# Altium schematic symbol library my_lib.SchLib: 341 symbols (part 1 of 2)
Pins are listed as number, name and electrical type; pins without a type are passive.

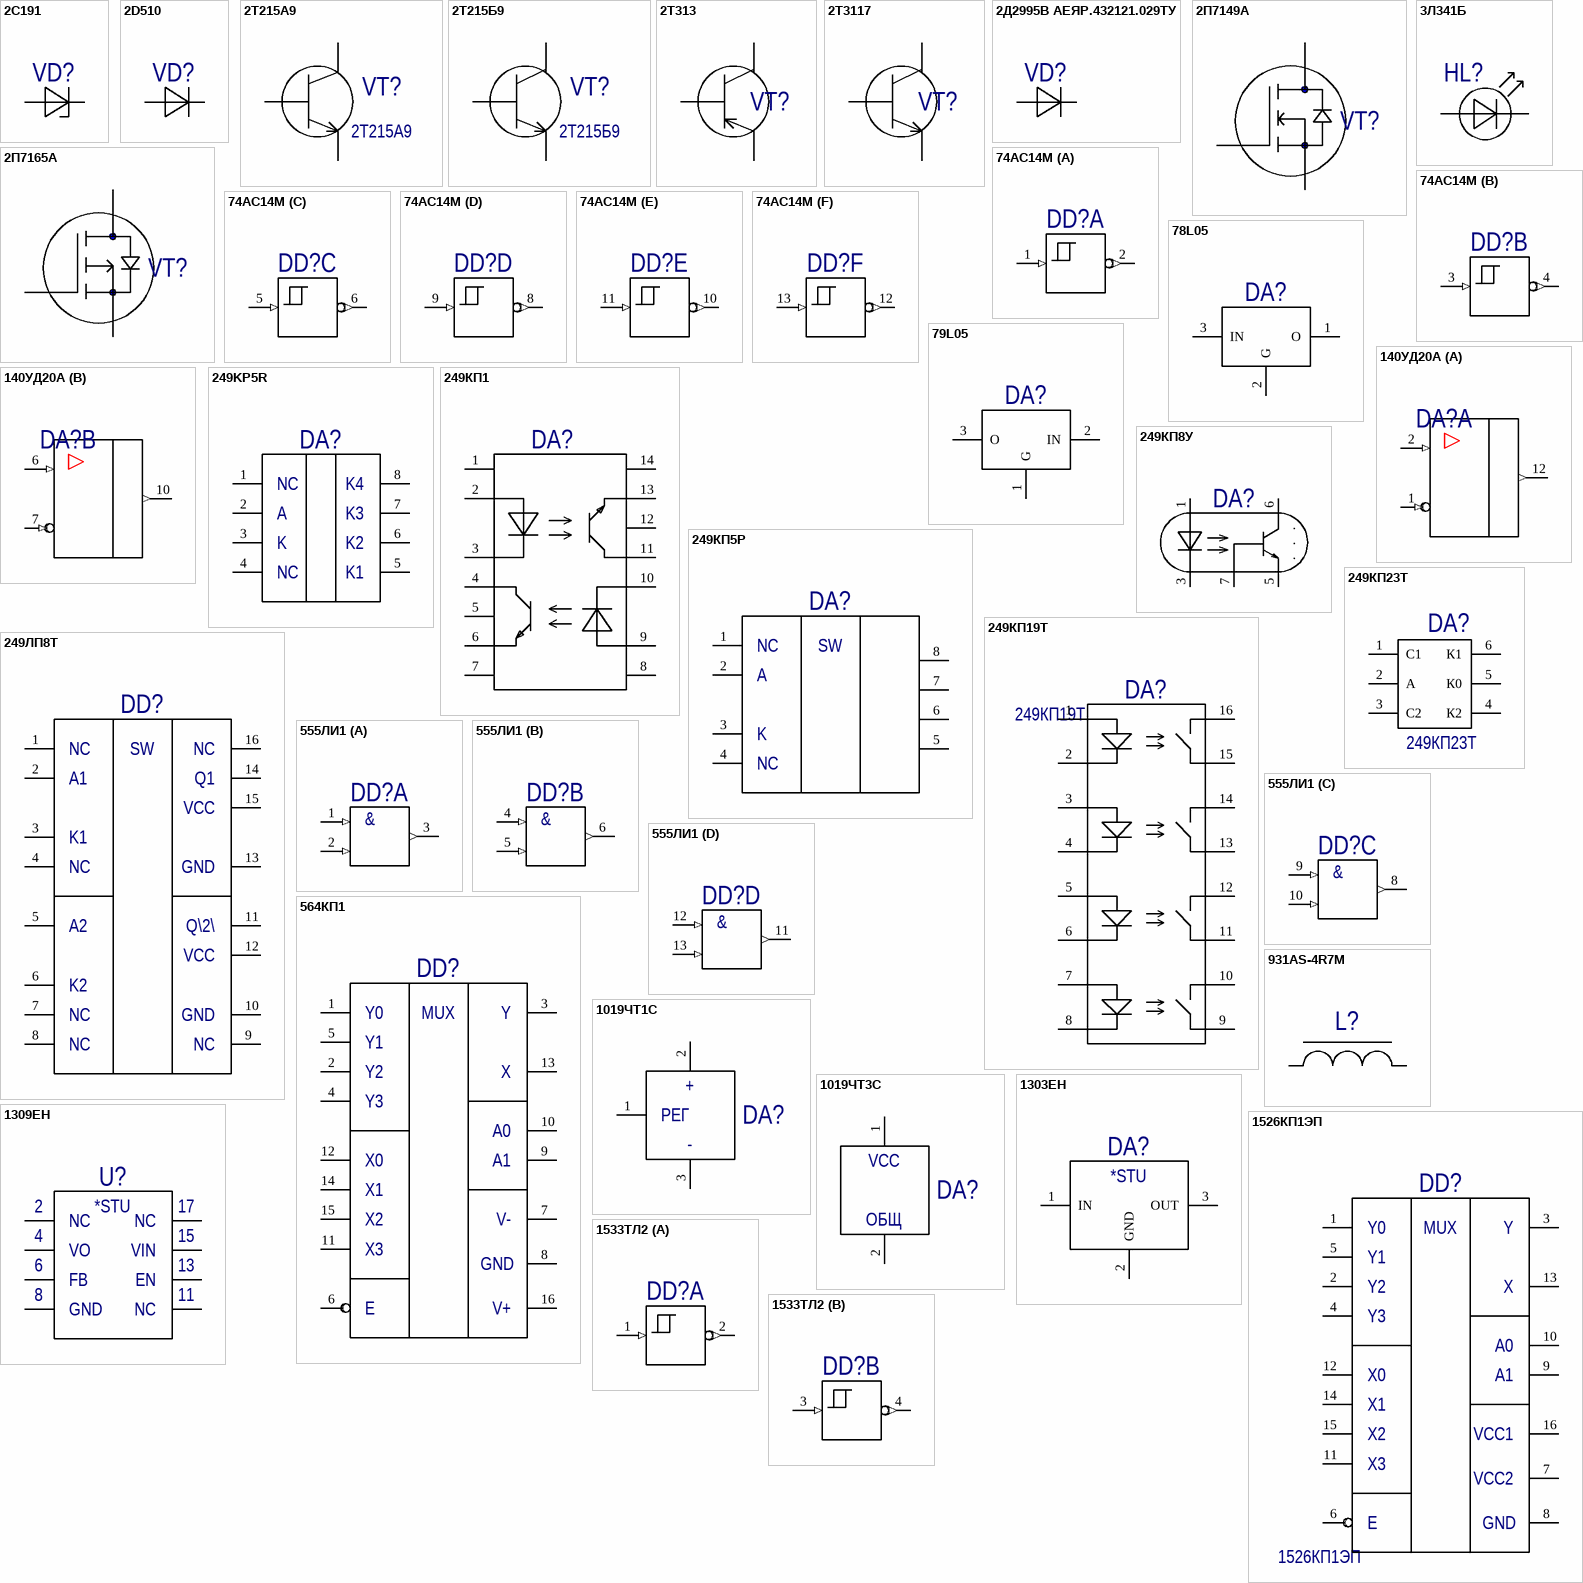
[diagram p0: symbols 2C191 to 1533ТЛ2]

## 2C191
designator VD?  (value not drawn)
Group: Диоды; Type: Type; TU: TU
pins: 1 0, 2 1

## 2D510
designator VD?  (value not drawn)
Group: Диоды; Type: Type; TU: TU
pins: 1 0, 2 1

## 2T215А9
designator VT?  Type: 2Т215А9  (hidden comment: 2T215А9)
Транзистор npn; Group: Транзисторы; TU: аА0.339.518 ТУ; Price: 10
footprint 2Т215А9
pins: 1 B, 2 C, 3 E

## 2T215Б9
designator VT?  Type: 2Т215Б9  (hidden comment: 2T215Б9)
Транзистор npn; Group: Транзисторы; TU: аА0.339.518 ТУ; Price: 10
footprint 2Т215А9
pins: 1 B, 2 C, 3 E

## 2T313
designator VT?  (value not drawn)
Group: Транзисторы; Type: Type; TU: TU
pins: 1 0, 2 0, 3 1

## 2T3117
designator VT?  (value not drawn)
Group: Транзисторы; Type: Type; TU: TU
footprint 2Т3117А
pins: 1 B, 2 C, 3 E

## 2Д2995B АЕЯР.432121.029ТУ
designator VD?  (value not drawn)
Group: Диоды; Type: Type; TU: TU
pins: 1 0, 2 1

## 2П7149А
designator VT?  (value not drawn)
Group: Транзисторы; Type: Type; TU: TU
footprint TO220
pins: 1 G, 2 D, 3 S

## 2П7165А
designator VT?  (value not drawn)
Group: Транзисторы; Type: Type; TU: TU
footprint TO220
pins: 1 G, 2 D, 3 S

## 3Л341Б
designator HL?  (value not drawn)
Group: Индикаторы единичные; Type: Type; TU: TU
pins: 1, 2

## 74AC14M
designator DD?
6 триггеров Шмидта SOP14; Manufacturer: STMicroelectronics; Group: Микросхемы; FullName: 74AC14M; Type: 74AC14M; TU: TU; Part Number: 74AC14M
footprint DIP14-RUS
pins on every part: 7 GND (power) hidden, 14 VCC (power) hidden
part A pins: 1 IN (in), 2 OUT (out)
part B pins: 3 IN (in), 4 OUT (out)
part C pins: 5 IN (in), 6 OUT (out)
part D pins: 8 OUT (out), 9 IN (in)
part E pins: 10 OUT (out), 11 IN (in)
part F pins: 12 OUT (out), 13 IN (in)

## 78L05
designator DA?  (value not drawn)
Group: Микросхемы; Type: Type; TU: TU
footprint 78LXX
pins: 1 O, 2 G, 3 IN

## 79L05
designator DA?  (value not drawn)
Group: Микросхемы; Type: Type; TU: TU
footprint 79LXX
pins: 1 G, 2 IN, 3 O

## 140УД20А
designator DA?  (value not drawn)
Group: Микросхемы; Type: Type; TU: TU
footprint 201.14-10
pins on every part: 3 hidden, 4 -15V (power) hidden, 5 hidden, 8 hidden, 9 +15V (power) hidden, 11 hidden, 13 +15V (power) hidden, 14 hidden
part A pins: 1 ~{IN} (in), 2 IN (in), 12 OUT (out)
part B pins: 6 IN (in), 7 ~{IN} (in), 10 OUT (out)

## 249KP5R
designator DA?  (value not drawn)
Group: Микросхемы; Type: Type; TU: TU
footprint 2101.8-7
pins: 1, 2, 3, 4, 5, 6, 7, 8
text: NC; K4; A; K3; K; K2; K1

## 249КП1
designator DA?  (value not drawn)
Group: Микросхемы; TU: 1Х3.438.000ТУ; FullName: 249КП1А 1Х3.438.000ТУ; Type: 249КП1А
pins: 1, 2, 3, 4, 5, 6, 7, 8, 9, 10, 11, 12, 13, 14

## 249КП5Р
designator DA?  (value not drawn)
Твердотельное реле 60В 1А; Manufacturer: Протон; Group: Микросхемы; TU: АЕЯР.431160.499 ТУ; FullName: 249КП5Р АЕЯР.431160.499 ТУ; Type: 249КП5Р
footprint 2101.8-7
pins: 1, 2, 3, 4, 5, 6, 7, 8
text: NC; SW; A; K

## 249КП8У
designator DA?  (value not drawn)
Group: Микросхемы; Type: Type; TU: TU
footprint 5140.8-АН3
pins: 1, 2, 3, 4, 5, 6, 7, 8

## 249КП19Т
designator DA?, comment Type: 249КП19Т  (hidden comment: Четырехканальное твердотельное реле 30В, 200мА)
Manufacturer: Протон; Group: Микросхемы; TU: АЕНВ.431160.077 ТУ; Price: 1000
pins: 1, 2, 3, 4, 5, 6, 7, 8, 9, 10, 11, 12, 13, 14, 15, 16

## 249КП23Т
designator DA?, comment Type: 249КП23Т  (hidden comment: Твердотельное реле 90В, 10А)
Manufacturer: ОАО "Протон"; Group: Микросхемы; TU: АЕНВ.431160.047 ТУ; Price: 5000
pins: 1 С1, 2 А, 3 С2, 4 К2, 5 К0, 6 К1

## 249ЛП8Т
designator DD?  (value not drawn)
Group: Микросхемы; Type: Type; TU: TU
footprint 402.16-23.01
pins: 1, 2, 3, 4, 5, 6, 7, 8, 9, 10, 11, 12, 13, 14, 15, 16
text: NC; SW; A1; Q1; VCC; K1; GND; A2; Q\2\; K2

## 555ЛИ1
designator DD?  (value not drawn)
Group: Микросхемы; Type: Type; TU: TU
footprint 2102.14-2
pins on every part: 7 GND (power) hidden, 14 VCC (power) hidden
part A pins: 1 IN1 (in), 2 IN2 (in), 3 OUT (out)
part B pins: 4 IN1 (in), 5 IN2 (in), 6 OUT (out)
part C pins: 8 OUT (out), 9 IN1 (in), 10 IN2 (in)
part D pins: 11 OUT (out), 12 IN1 (in), 13 IN2 (in)
part A text: &
part B text: &
part C text: &
part D text: &

## 564КП1
designator DD?  (value not drawn)
Group: Микросхемы; Type: Type; TU: TU
footprint 402.16-23.01
pins: 1, 2, 3, 4, 5, 6, 7, 8, 9, 10, 11, 12, 13, 14, 15, 16
text: Y0; MUX; Y; Y1; Y2; X; Y3; A0; X0; A1; X1; X2; V-; X3; GND; E; V+

## 931AS-4R7M
designator L?, comment Индуктивность TOKO 4,7uH, 8.5A  (value not drawn)
FullName: 931AS-4R7M; Value: 4.7uH; Group: Group; Type: Type; TU: TU; Part Number: 931AS-4R7M; Current: 8.5A
pins: 1 0, 2 1

## 1019ЧТ1С
designator DA?  (value not drawn)
Group: Микросхемы; Type: Type; TU: TU
pins: 1, 2, 3
text: +; РЕГ; -

## 1019ЧТ3С
designator DA?  (value not drawn)
Manufacturer: ЗАО "ОКБ МЭЛ"; Group: Микросхемы; TU: АЕЯР.431320.507 ТУ; Type: 1019ЧТ3С
pins: 1, 2
text: VCC; ОБЩ

## 1303ЕН
designator DA?, comment Линейный стабилизатор напряжения  (value not drawn)
Manufacturer: ЭлТом; Group: Микросхемы; TU: АЕЯР.431420.638 ТУ; FullName: 1303ЕНхх АЕЯР.431420.638 ТУ; Type: 1303ЕНхх
pins: 1 IN, 2 GND, 3 OUT
text: *STU

## 1309ЕН
designator U?  (value not drawn)
Group: Group; Type: Type; TU: TU
pins: 1, 2, 3, 4, 5, 6, 7, 8
text: *STU; 17; NC; 15; VO; VIN; 13; FB; EN; 11; GND

## 1526КП1ЭП
designator DD?, comment Type: 1526КП1ЭП  (hidden comment: Двойной 4 канальный мультиплексор)
Group: Микросхемы; TU: АЕЯР.431200.126-03ТУ; Price: 500
footprint 402.16-23.01
pins: 1, 2, 3, 4, 5, 6, 7, 8, 9, 10, 11, 12, 13, 14, 15, 16
text: Y0; MUX; Y; Y1; Y2; X; Y3; A0; X0; A1; X1; X2; VCC1; X3; VCC2; E; GND

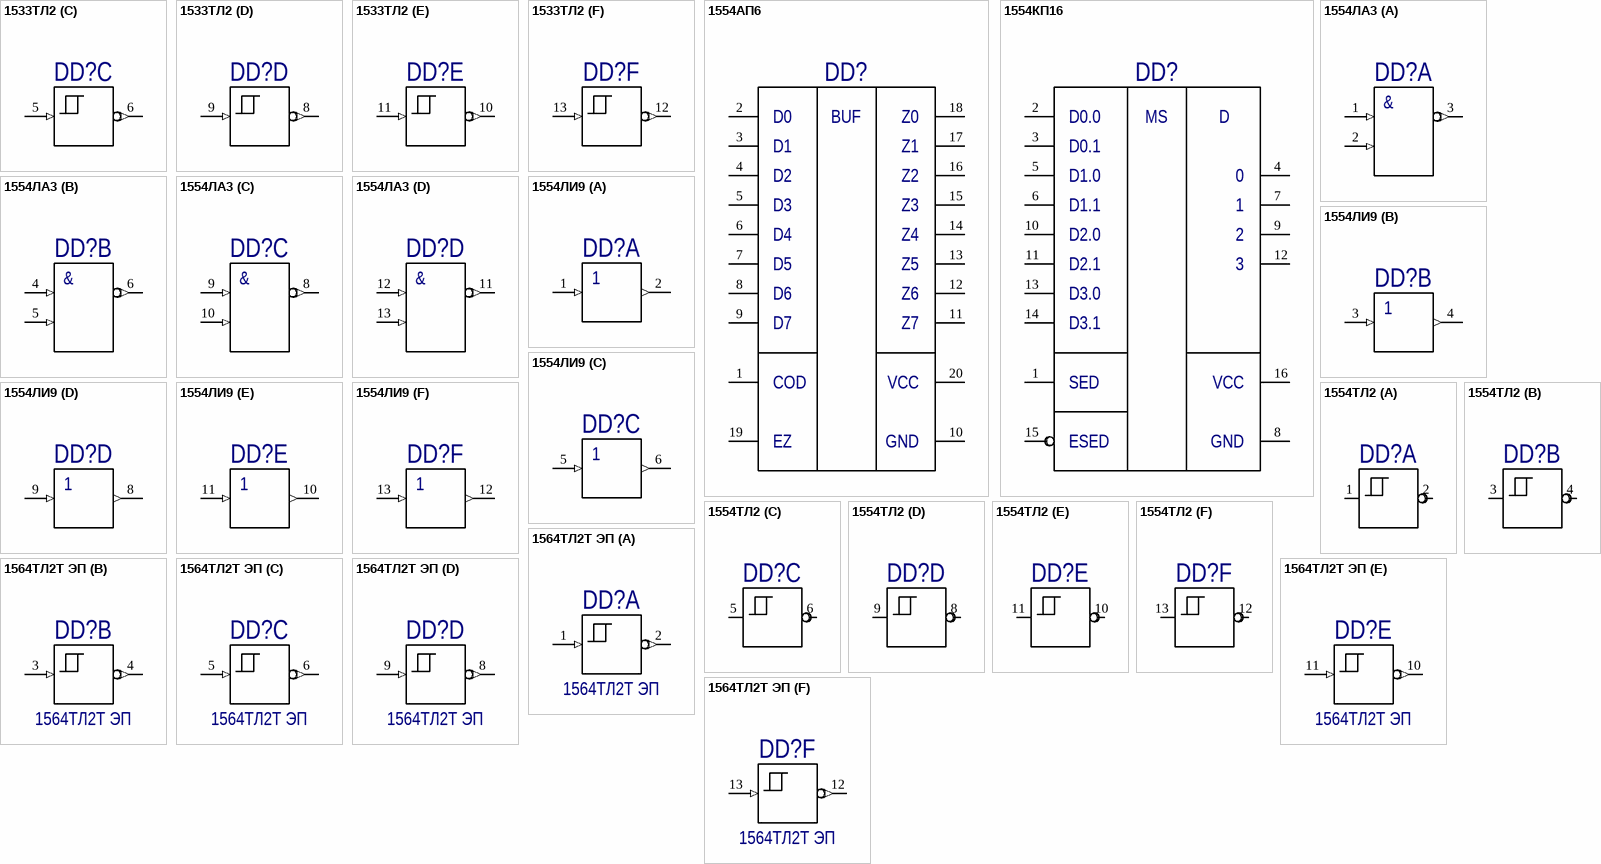
[diagram p1: symbols 1533ТЛ2 to 1564ТЛ2Т ЭП]

## 1533ТЛ2
designator DD?  (value not drawn)
Group: Микросхемы; Type: Type; TU: TU
pins on every part: 7 GND (power) hidden, 14 VCC (power) hidden
part A pins: 1 IN (in), 2 OUT (out)
part B pins: 3 IN (in), 4 OUT (out)
part C pins: 5 IN (in), 6 OUT (out)
part D pins: 8 OUT (out), 9 IN (in)
part E pins: 10 OUT (out), 11 IN (in)
part F pins: 12 OUT (out), 13 IN (in)

## 1554АП6
designator DD?  (value not drawn)
Group: Микросхемы; Type: Type; TU: TU
footprint 4153.20-6
pins: 1, 2, 3, 4, 5, 6, 7, 8, 9, 10 (power), 11, 12, 13, 14, 15, 16, 17, 18, 19, 20 (power)
text: D0; BUF; Z0; D1; Z1; D2; Z2; D3; Z3; D4; Z4; D5; Z5; D6; Z6; D7; Z7; COD; VCC; EZ; GND

## 1554КП16
designator DD?  (value not drawn)
Group: Микросхемы; Type: Type; TU: TU
pins: 1, 2, 3, 4, 5, 6, 7, 8 (power), 9, 10, 11, 12, 13, 14, 15, 16 (power)
text: D0.0; MS; D; D0.1; D1.0; 0; D1.1; D2.0; D2.1; D3.0; D3.1; SED; VCC; ESED; GND

## 1554ЛА3
designator DD?  (value not drawn)
Group: Микросхемы; Type: Type; TU: TU
pins on every part: 7 GND (power) hidden, 14 VCC (power) hidden
part A pins: 1 IN1 (in), 2 IN2 (in), 3 OUT (out)
part B pins: 4 IN1 (in), 5 IN2 (in), 6 OUT (out)
part C pins: 8 OUT (out), 9 IN1 (in), 10 IN2 (in)
part D pins: 11 OUT (out), 12 IN1 (in), 13 IN2 (in)
part A text: &
part B text: &
part C text: &
part D text: &

## 1554ЛИ9
designator DD?  (value not drawn)
Group: Микросхемы; Type: Type; TU: TU
pins on every part: 7 GND (power) hidden, 14 VCC (power) hidden
part A pins: 1 IN (in), 2 OUT (out)
part B pins: 3 IN (in), 4 OUT (out)
part C pins: 5 IN (in), 6 OUT (out)
part D pins: 8 OUT (out), 9 IN (in)
part E pins: 10 OUT (out), 11 IN (in)
part F pins: 12 OUT (out), 13 IN (in)

## 1554ТЛ2
designator DD?  (value not drawn)
Part Number: 1554ТЛ2ТБМ АЕЯР.431200.182-04ТУ; Group: Микросхемы; TU: АЕЯР.431200.182-04ТУ; Type: Type
footprint DIP14-RUS
pins on every part: 7 GND (power) hidden, 14 VCC (power) hidden
part A pins: 1 IN, 2 OUT
part B pins: 3 IN, 4 OUT
part C pins: 5 IN, 6 OUT
part D pins: 8 OUT, 9 IN
part E pins: 10 OUT, 11 IN
part F pins: 12 OUT, 13 IN

## 1564ТЛ2Т ЭП
designator DD?, comment Type: 1564ТЛ2Т ЭП  (hidden comment: 6 инвертирующих триггеров Шмидта)
Group: Микросхемы; TU: АЕНВ.431160.077 ТУ; Price: 500
footprint 401.14-5
pins on every part: 7 GND (power) hidden, 14 VCC (power) hidden
part A pins: 1 IN (in), 2 OUT (out)
part B pins: 3 IN (in), 4 OUT (out)
part C pins: 5 IN (in), 6 OUT (out)
part D pins: 8 OUT (out), 9 IN (in)
part E pins: 10 OUT (out), 11 IN (in)
part F pins: 12 OUT (out), 13 IN (in)

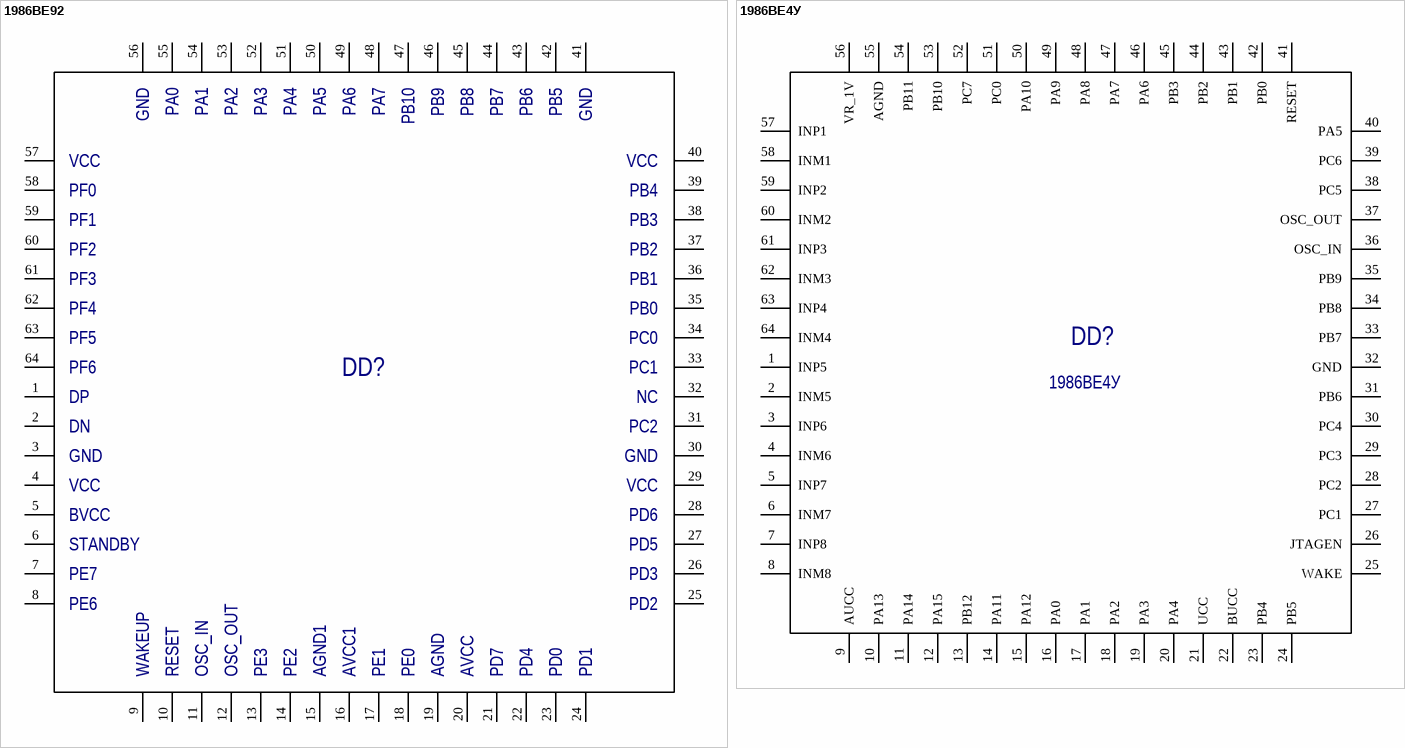
[diagram p2: symbols 1986BE92 to 1986ВЕ4У]

## 1986BE92
designator DD?  (value not drawn)
Group: Микросхемы; Type: Type; TU: TU
pins: 1, 2, 3, 4, 5, 6, 7, 8, 9, 10, 11, 12, 13, 14, 15, 16, 17, 18, 19, 20, 21, 22, 23, 24, 25, 26, 27, 28, 29, 30, 31, 32, 33, 34, 35, 36, 37, 38, 39, 40, 41, 42, 43, 44, 45, 46, 47, 48, 49, 50, 51, 52, 53, 54, 55, 56, 57, 58, 59, 60, 61, 62, 63, 64
text: GND; PA0; PA1; PA2; PA3; PA4; PA5; PA6; PA7; PB10; PB9; PB8; PB7; PB6; PB5; VCC; PF0; PB4; PF1; PB3; PF2; PB2; PF3; PB1; PF4; PB0; PF5; PC0; PF6; PC1; DP; NC; DN; PC2; BVCC; PD6; STANDBY; PD5; PE7; PD3; PE6; PD2; WAKEUP; RESET; OSC_IN; OSC_OUT; PE3; PE2; AGND1; AVCC1; PE1; PE0; AGND; AVCC; PD7; PD4; PD0; PD1

## 1986ВЕ4У
designator DD?
Микроконтроллер ARM CortexM3; Manufacturer: "Миландр"; Group: Микросхемы; TU: АЕЯР.431280.912ТУ; Price: 5000; Type: 1986ВЕ4У
pins: 1 INP5, 2 INM5, 3 INP6, 4 INM6, 5 INP7, 6 INM7, 7 INP8, 8 INM8, 9 AUCC, 10 PA13, 11 PA14, 12 PA15, 13 PB12, 14 PA11, 15 PA12, 16 PA0, 17 PA1, 18 PA2, 19 PA3, 20 PA4, 21 UCC, 22 BUCC, 23 PB4, 24 PB5, 25 WAKE, 26 JTAGEN, 27 PC1, 28 PC2, 29 PC3, 30 PC4, 31 PB6, 32 GND, 33 PB7, 34 PB8, 35 PB9, 36 OSC_IN, 37 OSC_OUT, 38 PC5, 39 PC6, 40 PA5, 41 RESET, 42 PB0, 43 PB1, 44 PB2, 45 PB3, 46 PA6, 47 PA7, 48 PA8, 49 PA9, 50 PA10, 51 PC0, 52 PC7, 53 PB10, 54 PB11, 55 AGND, 56 VR_1V, 57 INP1, 58 INM1, 59 INP2, 60 INM2, 61 INP3, 62 INM3, 63 INP4, 64 INM4

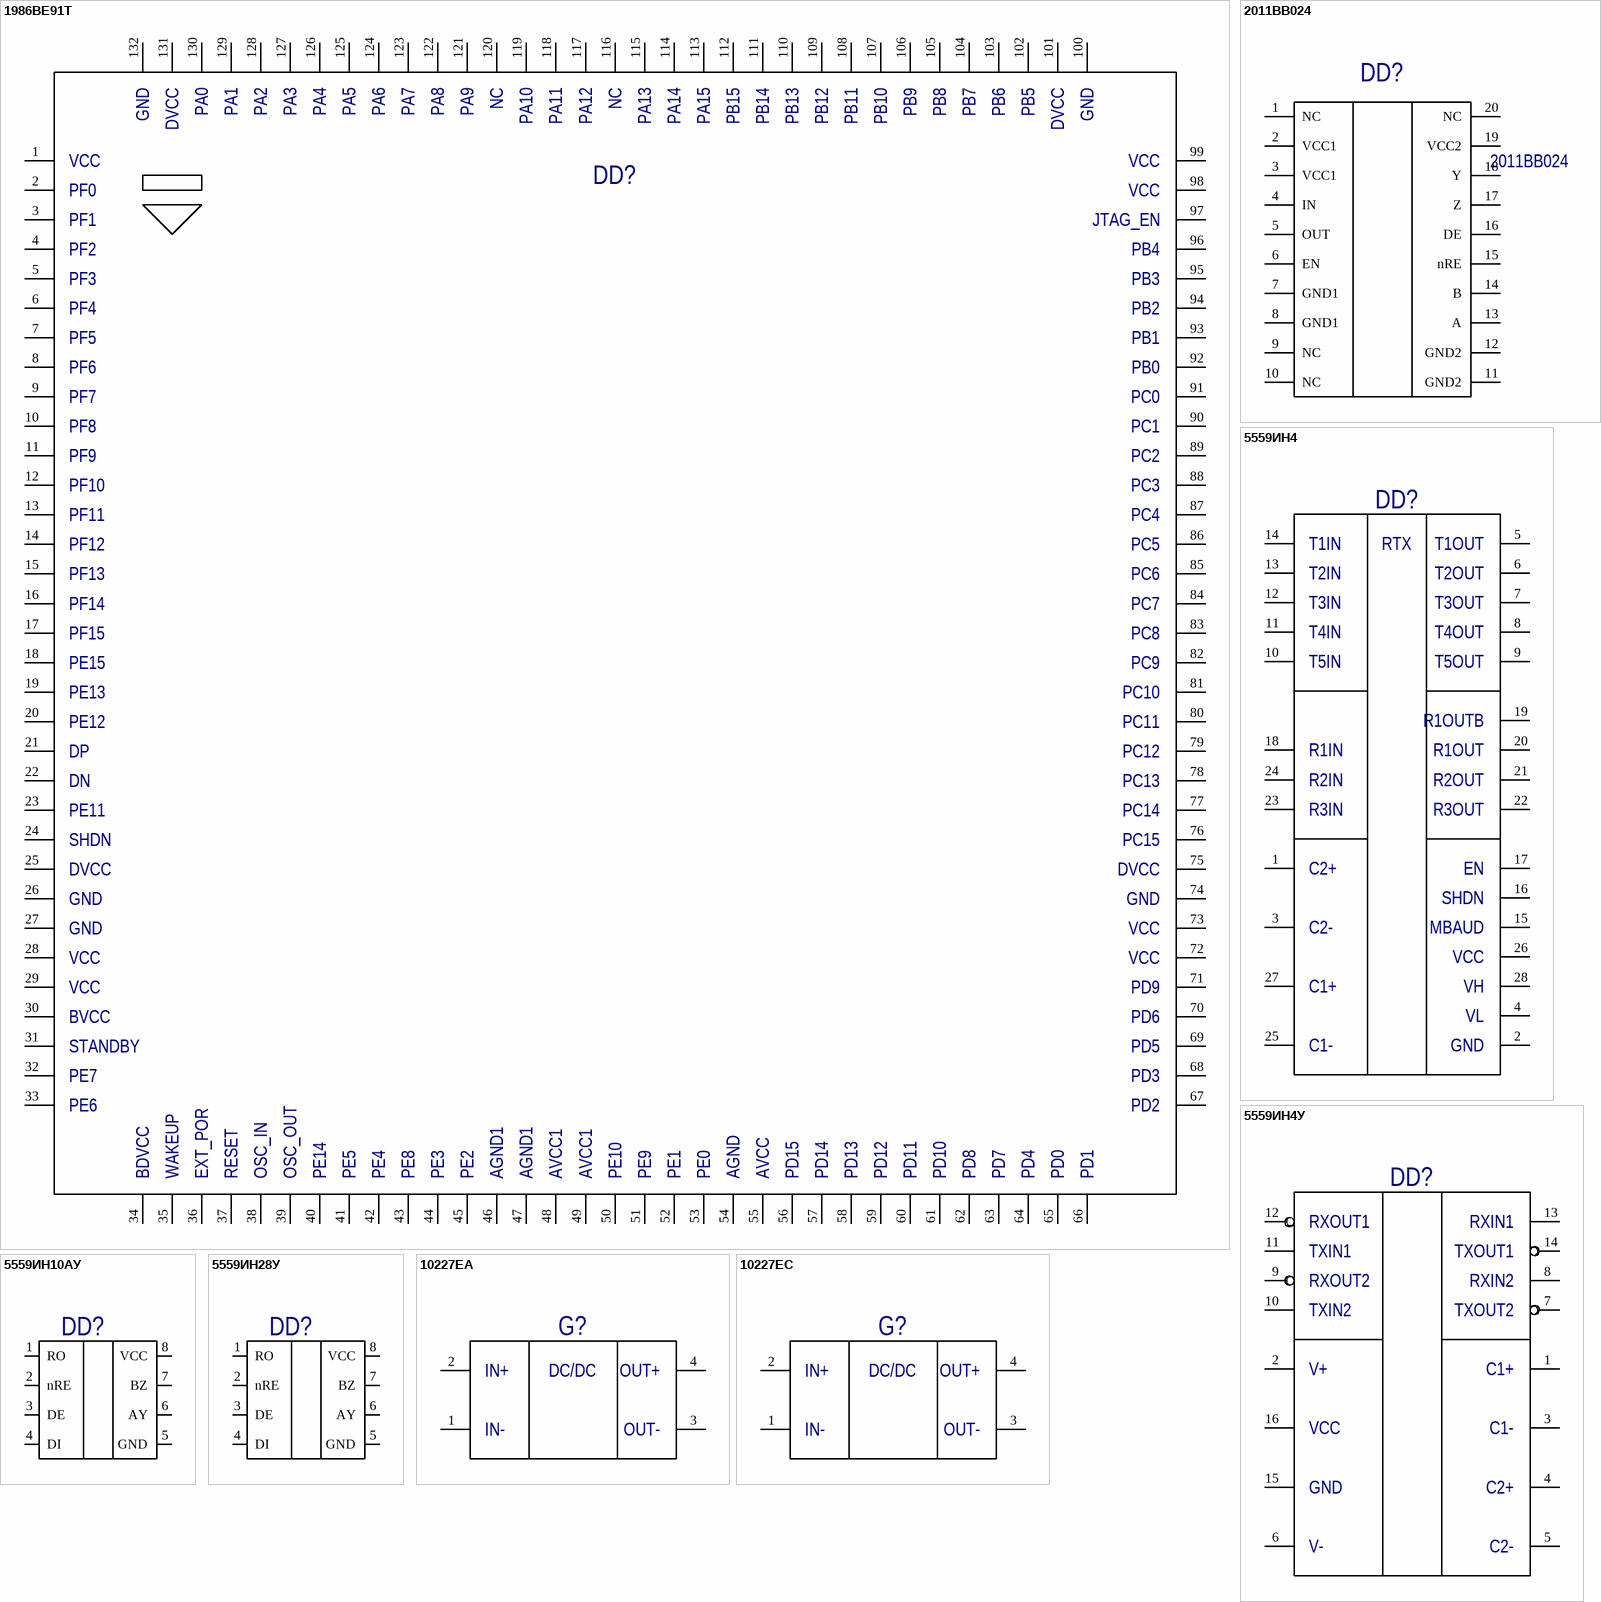
[diagram p3: symbols 1986ВЕ91Т to 10227EC]

## 1986ВЕ91Т
designator DD?  (value not drawn)
Group: Микросхемы; Type: Type; TU: TU
footprint 4229.132-3
pins: 1, 2, 3, 4, 5, 6, 7, 8, 9, 10, 11, 12, 13, 14, 15, 16, 17, 18, 19, 20, 21, 22, 23, 24, 25, 26, 27, 28, 29, 30, 31, 32, 33, 34, 35, 36, 37, 38, 39, 40, 41, 42, 43, 44, 45, 46, 47, 48, 49, 50, 51, 52, 53, 54, 55, 56, 57, 58, 59, 60, 61, 62, 63, 64, 65, 66, 67, 68, 69, 70, 71, 72, 73, 74, 75, 76, 77, 78, 79, 80, 81, 82, 83, 84, 85, 86, 87, 88, 89, 90, 91, 92, 93, 94, 95, 96, 97, 98, 99, 100, 101, 102, 103, 104, 105, 106, 107, 108, 109, 110, 111, 112, 113, 114, 115, 116, 117, 118, 119, 120, 121, 122, 123, 124, 125, 126, 127, 128, 129, 130, 131, 132
text: GND; DVCC; PA0; PA1; PA2; PA3; PA4; PA5; PA6; PA7; PA8; PA9; NC; PA10; PA11; PA12; PA13; PA14; PA15; PB15; PB14; PB13; PB12; PB11; PB10; PB9; PB8; PB7; PB6; PB5; VCC; PF0; PF1; JTAG_EN; PF2; PB4; PF3; PB3; PF4; PB2; PF5; PB1; PF6; PB0; PF7; PC0; PF8; PC1; PF9; PC2; PF10; PC3; PF11; PC4; PF12; PC5; PF13; PC6; PF14; PC7; PF15; PC8; PE15; PC9; PE13; PC10; PE12; PC11; DP; PC12; DN; PC13; PE11; PC14; SHDN; PC15; PD9; BVCC; PD6; STANDBY; PD5; PE7; PD3; PE6; PD2; BDVCC; WAKEUP; EXT_POR; RESET; OSC_IN; OSC_OUT; PE14; PE5; PE4; PE8; PE3; PE2; AGND1; AVCC1; PE10; PE9; PE1; PE0; AGND; AVCC; PD15; PD14; PD13; PD12; PD11; PD10; PD8; PD7; PD4; PD0; PD1

## 2011ВВ024
designator DD?
Гальванически изолированный приемопередатчик RS485; Group: Микросхемы; Price: 1000; Type: 2011ВВ024
pins: 1 NC, 2 VCC1, 3 VCC1, 4 IN, 5 OUT, 6 EN, 7 GND1, 8 GND1, 9 NC, 10 NC, 11 GND2, 12 GND2, 13 A, 14 B, 15 nRE, 16 DE, 17 Z, 18 Y, 19 VCC2, 20 NC

## 5559ИН4
designator DD?  (value not drawn)
Group: Микросхемы; Type: Type; TU: TU
pins: 1, 2, 3, 4, 5, 6, 7, 8, 9, 10, 11, 12, 13, 14, 15, 16, 17, 18, 19, 20, 21, 22, 23, 24, 25, 26, 27, 28
text: T1IN; RTX; T1OUT; T2IN; T2OUT; T3IN; T3OUT; T4IN; T4OUT; T5IN; T5OUT; R1OUTB; R1IN; R1OUT; R2IN; R2OUT; R3IN; R3OUT; C2+; EN; SHDN; C2-; MBAUD; VCC; C1+; VH; VL; C1-; GND

## 5559ИН4У
designator DD?  (value not drawn)
Group: Микросхемы; Type: Type; TU: TU
pins: 1, 2, 3, 4, 5, 6, 7, 8, 9, 10, 11, 12, 13, 14, 15 (power), 16 (power)
text: RXOUT1; RXIN1; TXIN1; TXOUT1; RXOUT2; RXIN2; TXIN2; TXOUT2; V+; C1+; VCC; C1-; GND; C2+; V-; C2-

## 5559ИН10АУ
designator DD?  (value not drawn)
Manufacturer: "Миландр"; Group: Микросхемы; TU: АЕЯР.431230.645 ТУ; Type: 5559ИН10АУ
pins: 1 RO, 2 nRE, 3 DE, 4 DI, 5 GND, 6 AY, 7 BZ, 8 VCC

## 5559ИН28У
designator DD?, comment Приемопередатчик RS-485  (value not drawn)
Manufacturer: "Миландр"; Group: Микросхемы; TU: АЕЯР.431230.882ТУ; Type: 5559ИН28У
pins: 1 RO, 2 nRE, 3 DE, 4 DI, 5 GND, 6 AY, 7 BZ, 8 VCC

## 10227EA
designator G?  (value not drawn)
Group: Модули питания; Type: Type; TU: TU
pins: 1, 2, 3, 4
text: IN+; DC/DC; OUT+; IN-; OUT-

## 10227EC
designator G?  (value not drawn)
Group: Модули питания; Type: Type; TU: TU
pins: 1, 2, 3, 4
text: IN+; DC/DC; OUT+; IN-; OUT-

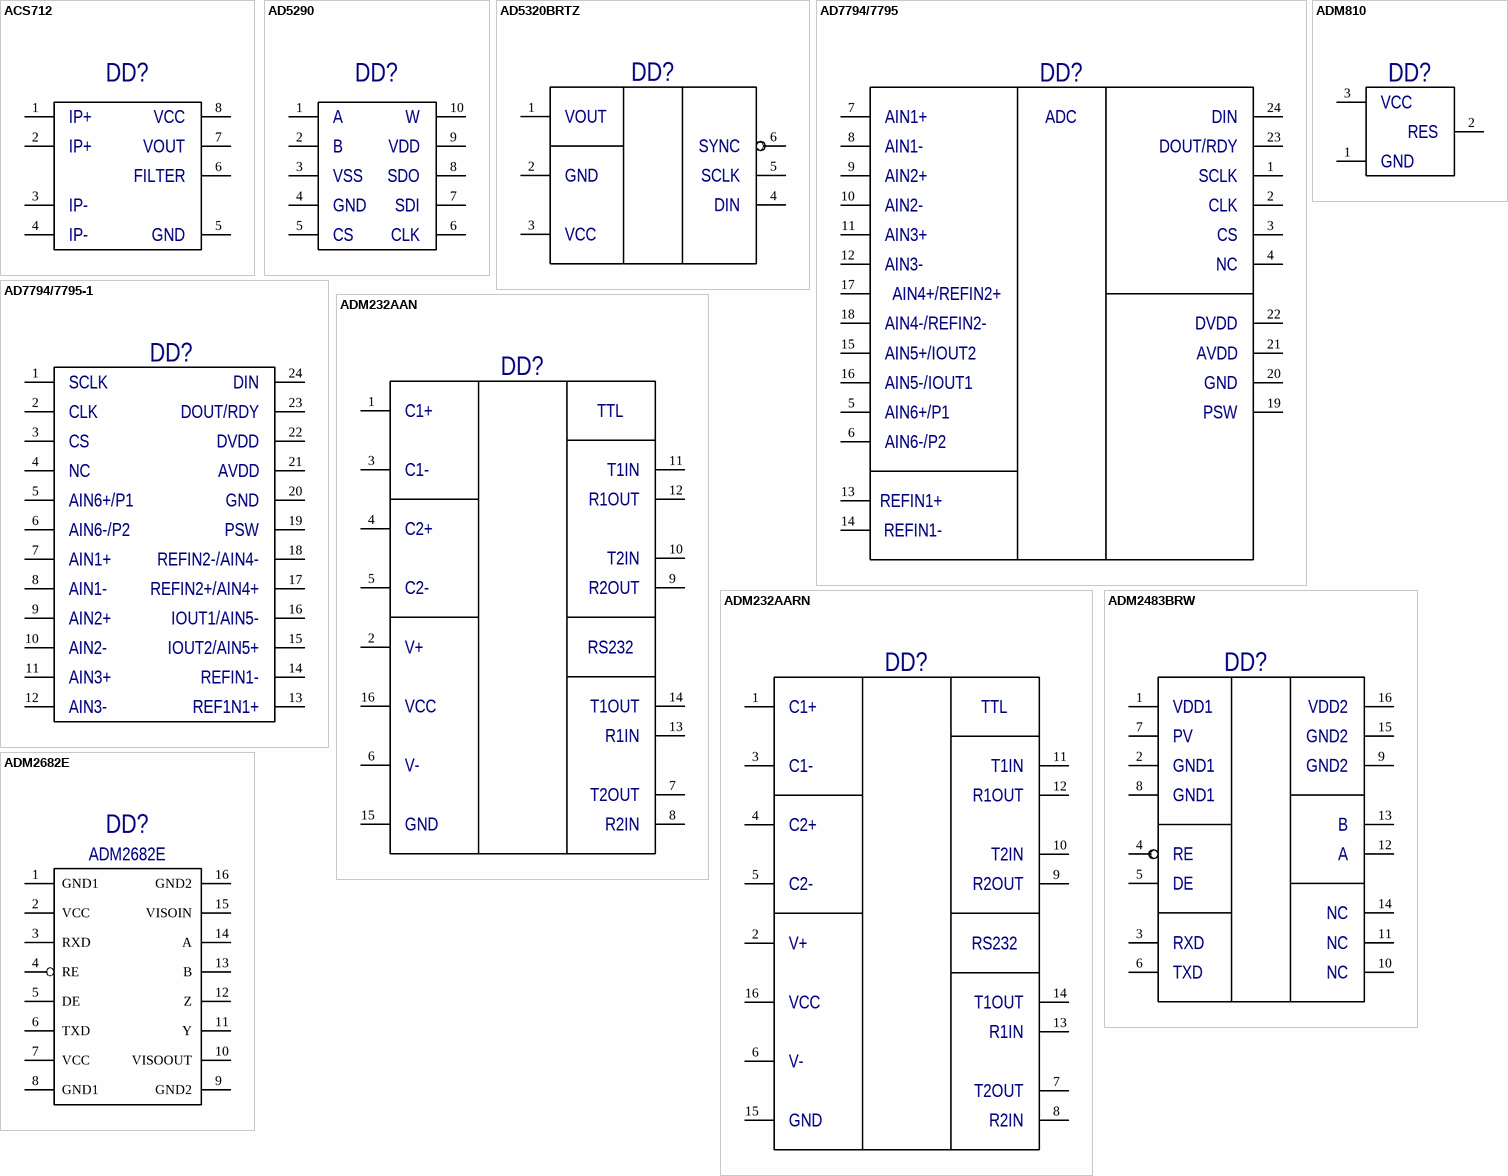
[diagram p4: symbols ACS712 to ADM2682E]

## ACS712
designator DD?  (value not drawn)
Group: Микросхемы; Type: Type; TU: TU
pins: 1, 2, 3, 4, 5, 6, 7, 8
text: IP+; VCC; VOUT; FILTER; IP-; GND

## AD5290
designator DD?  (value not drawn)
Manufacturer: Analog Devices; Group: Микросхемы; Type: Type; TU: TU
footprint RM-10
pins: 1, 2, 3, 4, 5, 6, 7, 8, 9, 10
text: A; W; B; VDD; VSS; SDO; GND; SDI; CS; CLK

## AD5320BRTZ
designator DD?  (value not drawn)
Manufacturer: Analog Devices; Group: Микросхемы; Type: Type; TU: TU
footprint RT-6
pins: 1, 2, 3, 4, 5, 6
text: VOUT; SYNC; GND; SCLK; DIN; VCC

## AD7794/7795
designator DD?  (value not drawn)
Manufacturer: Analog Devices; Group: Микросхемы; Type: Type; TU: TU
footprint AD7794BRU
pins: 1, 2, 3, 4, 5, 6, 7, 8, 9, 10, 11, 12, 13, 14, 15, 16, 17, 18, 19, 20, 21, 22, 23, 24
text: AIN1+; ADC; DIN; AIN1-; DOUT/RDY; AIN2+; SCLK; AIN2-; CLK; AIN3+; CS; AIN3-; NC; AIN4+/REFIN2+; AIN4-/REFIN2-; DVDD; AIN5+/IOUT2; AVDD; AIN5-/IOUT1; GND; AIN6+/P1; PSW; AIN6-/P2; REFIN1+; REFIN1-

## AD7794/7795-1
designator DD?  (value not drawn)
Part Number: AD7794BRU; Manufacturer: Analog Devices; Group: Микросхемы; Type: Type; TU: TU
footprint AD7794BRU
pins: 1, 2, 3, 4, 5, 6, 7, 8, 9, 10, 11, 12, 13, 14, 15, 16, 17, 18 REFIN2+/AUN4+, 19, 20, 21, 22, 23, 24
text: SCLK; DIN; CLK; DOUT/RDY; CS; DVDD; NC; AVDD; AIN6+/P1; GND; AIN6-/P2; PSW; AIN1+; REFIN2-/AIN4-; AIN1-; REFIN2+/AIN4+; AIN2+; IOUT1/AIN5-; AIN2-; IOUT2/AIN5+; AIN3+; REFIN1-; AIN3-; REF1N1+

## ADM232AAN
designator DD?  (value not drawn)
Manufacturer: Analog Devices; Group: Микросхемы; Type: Type; TU: TU
footprint DIP16
pins: 1, 2, 3, 4, 5, 6, 7, 8, 9, 10, 11, 12, 13, 14, 15, 16
text: C1+; TTL; C1-; T1IN; R1OUT; C2+; T2IN; C2-; R2OUT; V+; RS232; VCC; T1OUT; R1IN; V-; T2OUT; GND; R2IN

## ADM232AARN
designator DD?
Приемопередатчик RS232 SOIC-16 (R-16N); Part Number: ADM232AARN; Manufacturer: Analog Devices; Group: Микросхемы; Type: Type
pins: 1, 2, 3, 4, 5, 6, 7, 8, 9, 10, 11, 12, 13, 14, 15, 16
text: C1+; TTL; C1-; T1IN; R1OUT; C2+; T2IN; C2-; R2OUT; V+; RS232; VCC; T1OUT; R1IN; V-; T2OUT; GND; R2IN

## ADM810
designator DD?  (value not drawn)
Manufacturer: Analog Devices; Group: Микросхемы; Type: Type; TU: TU
pins: 1, 2, 3
text: VCC; RES; GND

## ADM2483BRW
designator DD?  (value not drawn)
Manufacturer: Analog Devices; Group: Микросхемы; Type: Type; TU: TU
pins: 1 (power), 2 (power), 3, 4, 5, 6, 7, 8 (power), 9 (power), 10, 11, 12, 13, 14, 15 (power), 16 (power)
text: VDD1; VDD2; PV; GND2; GND1; B; RE; A; DE; NC; RXD; TXD

## ADM2682E
designator DD?
Manufacturer: Analog Devices; Group: Микросхемы; TU: TU; FullName: ADM2682E; Part Number: ADM2682E; Type: ADM2682E
pins: 1 GND1 (power), 2 VCC (power), 3 RXD, 4 RE, 5 DE, 6 TXD, 7 VCC, 8 GND1 (power), 9 GND2 (power), 10 VISOOUT, 11 Y, 12 Z, 13 B, 14 A, 15 VISOIN (power), 16 GND2 (power)

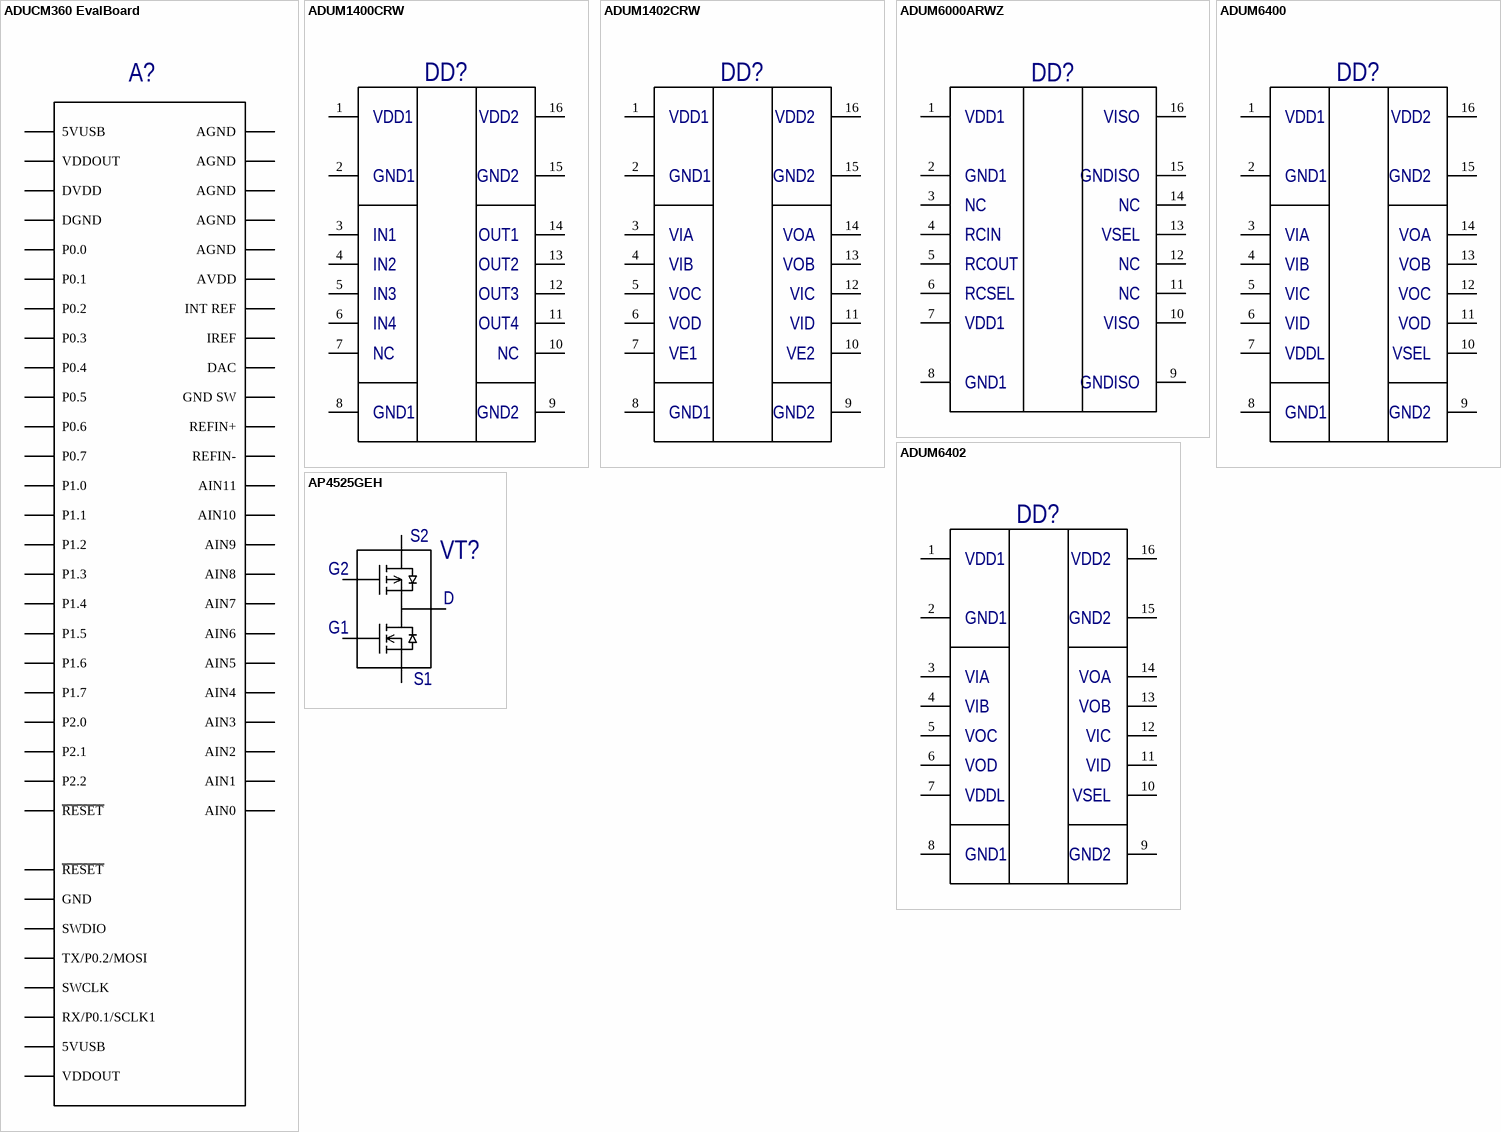
[diagram p5: symbols ADUCM360 EvalBoard to AP4525GEH]

## ADUCM360 EvalBoard
designator A?
Manufacturer: Analog Devices; Group: Устройства; FullName: EVAL-AUCM360MKZ; Type: Type; TU: TU; Part Number: EVAL-AUCM360MKZ
pins: 1 5VUSB, 1 AGND, 1 ~{RESET}, 2 VDDOUT, 2 AGND, 2 GND, 3 DVDD, 3 AGND, 3 TX/P0.2/MOSI, 4 DGND, 4 AGND, 4 SWCLK, 5 P0.0, 5 AGND, 5 RX/P0.1/SCLK1, 6 P0.1, 6 AVDD, 6 5VUSB, 7 P0.2, 7 INT REF, 7 VDDOUT, 8 P0.3, 8 DAC, 9 P0.4, 9 GND SW, 10 P0.5, 10 REFIN+, 11 P0.6, 11 REFIN-, 12 P0.7, 12 AIN11, 13 P1.0, 13 AIN10, 14 P1.1, 14 AIN9, 15 P1.2, 15 AIN8, 16 P1.3, 16 AIN7, 17 P1.4, 17 AIN6, 18 P1.5, 18 AIN5, 19 P1.6, 19 AIN4, 20 P1.7, 20 AIN3, 21 P2.0, 21 AIN2, 22 P2.1, 22 AIN1, 23 P2.2, 23 AIN0, 24 ~{RESET}, 24 IREF, 24 SWDIO

## ADUM1400CRW
designator DD?  (value not drawn)
Manufacturer: Analog Devices; Group: Микросхемы; Type: Type; TU: TU
footprint SOIC-RW16
pins: 1, 2, 3, 4, 5, 6, 7, 8, 9, 10, 11, 12, 13, 14, 15, 16
text: VDD1; VDD2; GND1; GND2; IN1; OUT1; IN2; OUT2; IN3; OUT3; IN4; OUT4; NC

## ADUM1402CRW
designator DD?  (value not drawn)
Manufacturer: Analog Devices; Group: Микросхемы; Type: Type; TU: TU
pins: 1, 2, 3, 4, 5, 6, 7, 8, 9, 10, 11, 12, 13, 14, 15, 16
text: VDD1; VDD2; GND1; GND2; VIA; VOA; VIB; VOB; VOC; VIC; VOD; VID; VE1; VE2

## ADUM6000ARWZ
designator DD?  (value not drawn)
Manufacturer: Analog Devices; Group: Микросхемы; Type: Type; TU: TU
pins: 1, 2, 3, 4, 5, 6, 7, 8, 9, 10, 11, 12, 13, 14, 15, 16
text: VDD1; VISO; GND1; GNDISO; NC; RCIN; VSEL; RCOUT; RCSEL

## ADUM6400
designator DD?  (value not drawn)
Микросхема гальванической изоляции с встроенным DC/DC 4 вых; Manufacturer: Analog Devices; Group: Микросхемы; FullName: ADUM6400CRWZ; Type: ADUM6400CRWZ; TU: TU; Price: 500
footprint SOIC-RW16
pins: 1, 2, 3, 4, 5, 6, 7, 8, 9, 10, 11, 12, 13, 14, 15, 16
text: VDD1; VDD2; GND1; GND2; VIA; VOA; VIB; VOB; VIC; VOC; VID; VOD; VDDL; VSEL

## ADUM6402
designator DD?  (value not drawn)
Микросхема гальванической изоляции с встроенным DC/DC 2вх+2вых; Manufacturer: Analog Devices; Group: Микросхемы; FullName: ADUM6402CRWZ; Type: ADUM6402CRWZ; TU: TU; Price: 500
footprint SOIC-RW16
pins: 1, 2, 3, 4, 5, 6, 7, 8, 9, 10, 11, 12, 13, 14, 15, 16
text: VDD1; VDD2; GND1; GND2; VIA; VOA; VIB; VOB; VOC; VIC; VOD; VID; VDDL; VSEL

## AP4525GEH
designator VT?  (value not drawn)
Комплиментарная пара p и n MOSFET TO-252-4L; Group: Транзисторы; Type: Type; TU: TU; FullName: AP4525GEH; Part Number: AP4525GEH
pins: 1 G, 1 G, 2 D, 2 D, 3 S
text: S2; G2; G1; S1

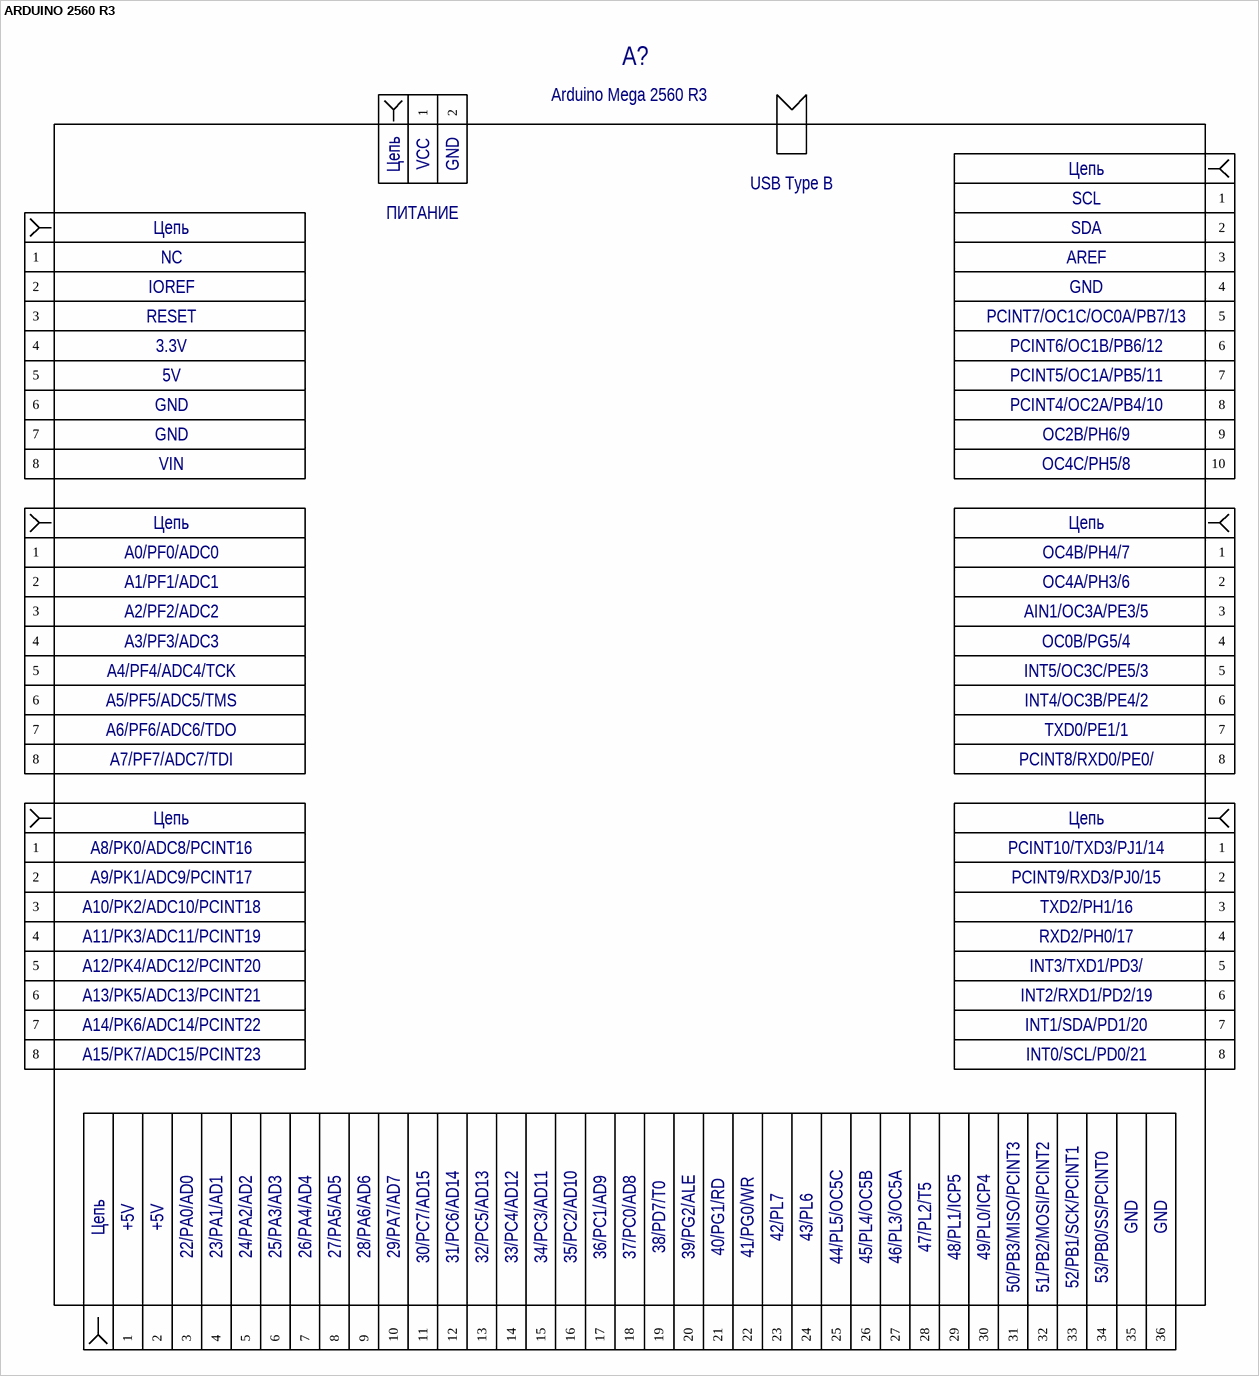
[diagram p6: symbol ARDUINO 2560 R3]

## ARDUINO 2560 R3
designator A?, comment Arduino Mega 2560 R3
Group: *; Manufacturer: Arduino; Type: Arduino Mega 2560 R3
pins: ?1 1, ?2 2, ?3 3, ?4 4, ?5 5, ?6 6, ?7 7, ?8 8, ?9 1, ?10 2, ?11 3, ?12 4, ?13 5, ?14 6, ?15 7, ?16 8, ?17 1, ?18 2, ?19 3, ?20 4, ?21 5, ?22 6, ?23 7, ?24 8, ?25 1, ?26 2, ?27 3, ?28 4, ?29 5, ?30 6, ?31 7, ?32 8, ?33 9, ?34 10, ?35 11, ?36 12, ?37 13, ?38 14, ?39 15, ?40 16, ?41 17, ?42 18, ?43 19, ?44 20, ?45 21, ?46 22, ?47 23, ?48 24, ?49 25, ?50 26, ?51 27, ?52 28, ?53 29, ?54 30, ?55 31, ?56 32, ?57 33, ?58 34, ?59 35, ?60 36, ?61 1, ?62 2, ?63 3, ?64 4, ?65 5, ?66 6, ?67 7, ?68 8, ?69 1, ?70 2, ?71 3, ?72 4, ?73 5, ?74 6, ?75 7, ?76 8, ?77 1, ?78 2, ?79 3, ?80 4, ?81 5, ?82 6, ?83 7, ?84 8, ?85 9, ?86 10, ?87 1, ?88 2
text: Цепь; VCC; GND; USB Type B; SCL; ПИТАНИЕ; SDA; NC; AREF; IOREF; RESET; PCINT7/OC1C/OC0A/PB7/13; 3.3V; PCINT6/OC1B/PB6/12; 5V; PCINT5/OC1A/PB5/11; PCINT4/OC2A/PB4/10; OC2B/PH6/9; VIN; OC4C/PH5/8; A0/PF0/ADC0; OC4B/PH4/7; A1/PF1/ADC1; OC4A/PH3/6; A2/PF2/ADC2; AIN1/OC3A/PE3/5; A3/PF3/ADC3; OC0B/PG5/4; A4/PF4/ADC4/TCK; INT5/OC3C/PE5/3; A5/PF5/ADC5/TMS; INT4/OC3B/PE4/2; A6/PF6/ADC6/TDO; TXD0/PE1/1; A7/PF7/ADC7/TDI; PCINT8/RXD0/PE0/; A8/PK0/ADC8/PCINT16; PCINT10/TXD3/PJ1/14; A9/PK1/ADC9/PCINT17; PCINT9/RXD3/PJ0/15; A10/PK2/ADC10/PCINT18; TXD2/PH1/16; A11/PK3/ADC11/PCINT19; RXD2/PH0/17; A12/PK4/ADC12/PCINT20; INT3/TXD1/PD3/; A13/PK5/ADC13/PCINT21; INT2/RXD1/PD2/19; A14/PK6/ADC14/PCINT22; INT1/SDA/PD1/20; A15/PK7/ADC15/PCINT23; INT0/SCL/PD0/21; +5V; 22/PA0/AD0; 23/PA1/AD1; 24/PA2/AD2; 25/PA3/AD3; 26/PA4/AD4; 27/PA5/AD5; 28/PA6/AD6; 29/PA7/AD7; 30/PC7/AD15; 31/PC6/AD14; 32/PC5/AD13; 33/PC4/AD12; 34/PC3/AD11; 35/PC2/AD10; 36/PC1/AD9; 37/PC0/AD8; 38/PD7/T0; 39/PG2/ALE; 40/PG1/RD; 41/PG0/WR; 42/PL7; 43/PL6; 44/PL5/OC5C; 45/PL4/OC5B; 46/PL3/OC5A; 47/PL2/T5; 48/PL1/ICP5; 49/PL0/ICP4; 50/PB3/MISO/PCINT3; 51/PB2/MOSI/PCINT2; 52/PB1/SCK/PCINT1; 53/PB0/SS/PCINT0

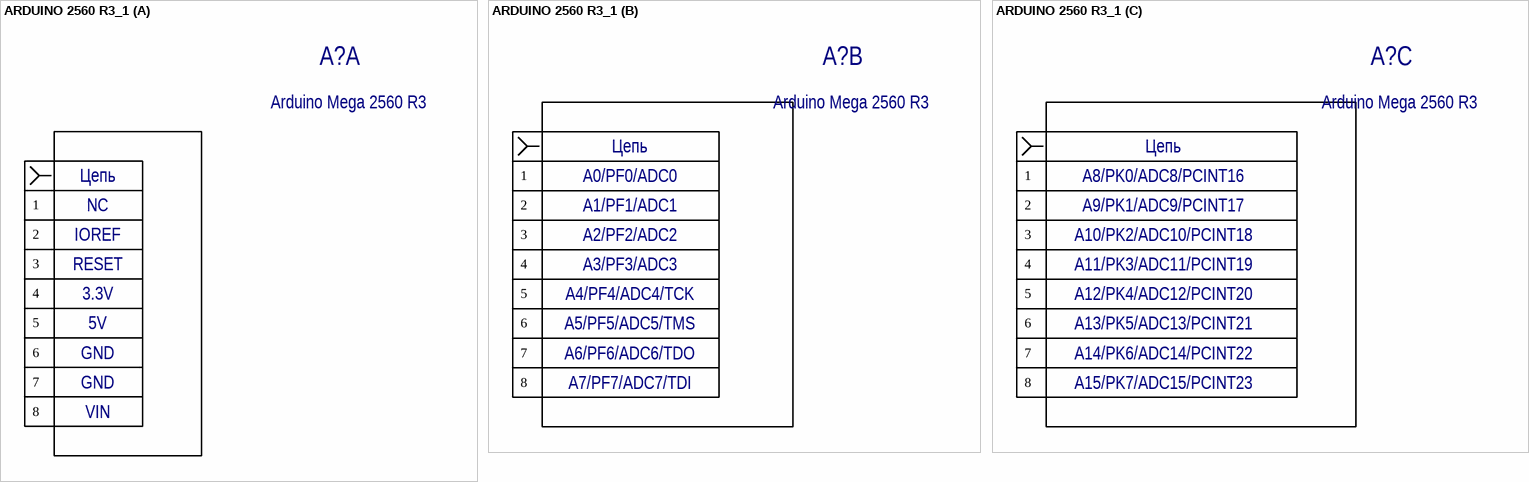
[diagram p7: symbol ARDUINO 2560 R3_1]

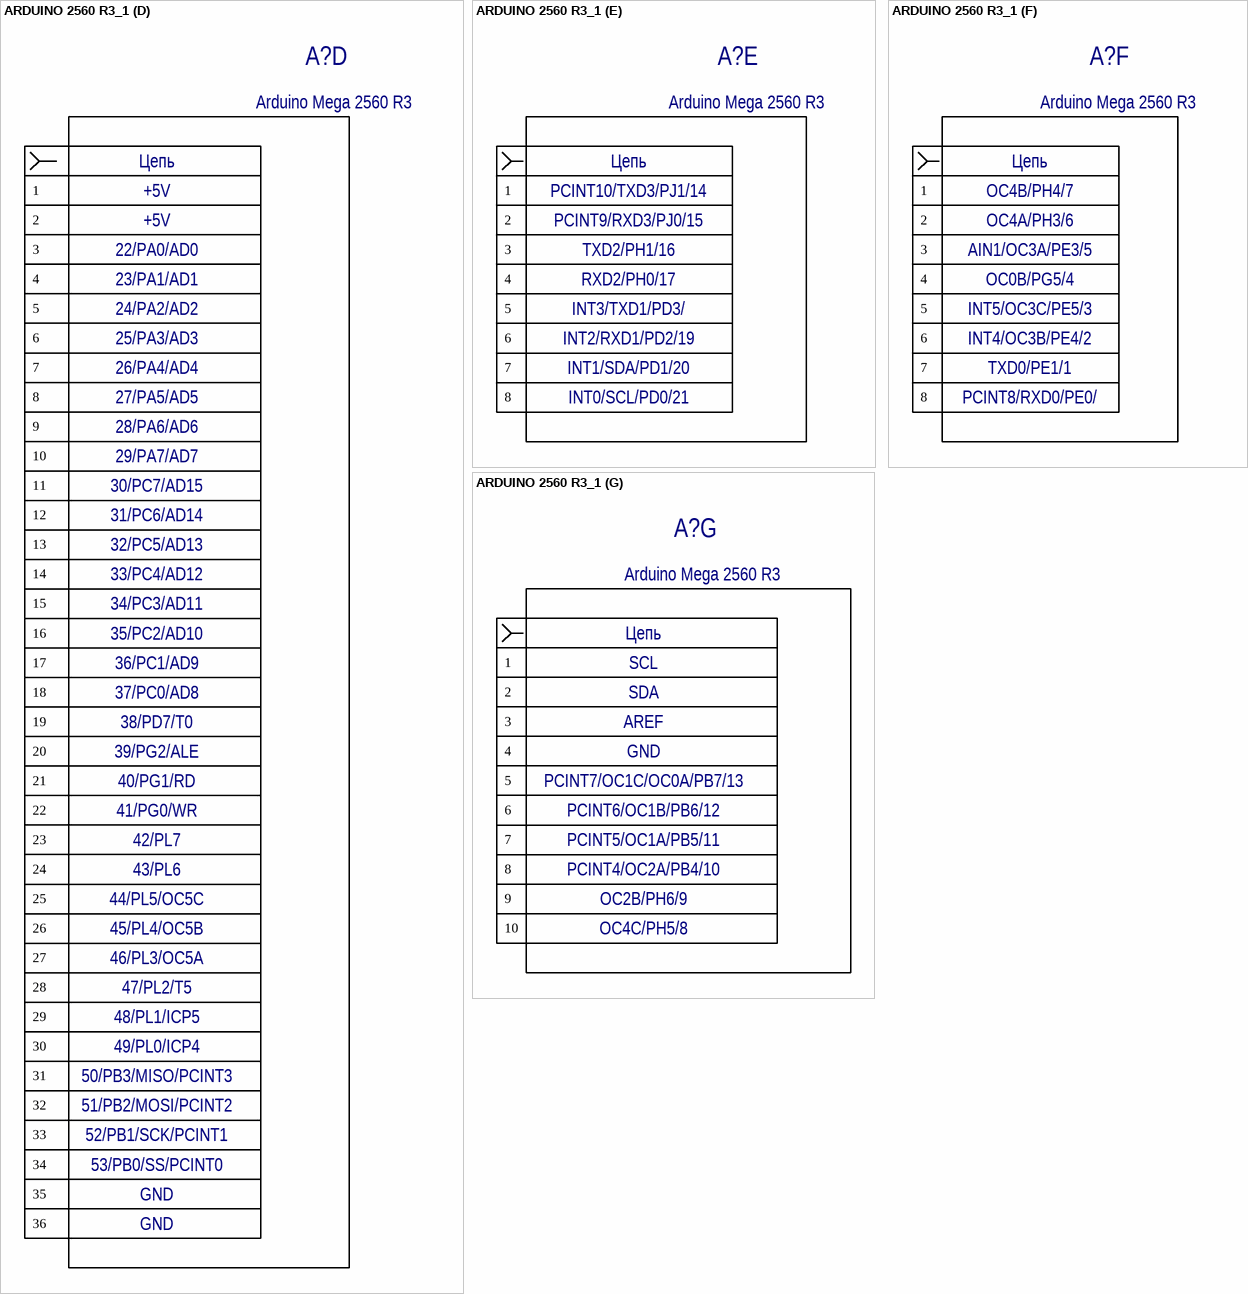
[diagram p8: symbol ARDUINO 2560 R3_1]

## ARDUINO 2560 R3_1
designator A?, comment Arduino Mega 2560 R3
Group: Модули радиоэлектронные; Price: 2000; Manufacturer: Arduino; Type: Arduino Mega 2560 R3
part A pins: ?1 1, ?2 2, ?3 3, ?4 4, ?5 5, ?6 6, ?7 7, ?8 8
part B pins: ? 1, ? 2, ? 3, ? 4, ? 5, ? 6, ? 7, ? 8
part C pins: ? 1, ? 2, ? 3, ? 4, ? 5, ? 6, ? 7, ? 8
part D pins: ? 1, ? 2, ? 3, ? 4, ? 5, ? 6, ? 7, ? 8, ? 9, ? 10, ? 11, ? 12, ? 13, ? 14, ? 15, ? 16, ? 17, ? 18, ? 19, ? 20, ? 21, ? 22, ? 23, ? 24, ? 25, ? 26, ? 27, ? 28, ? 29, ? 30, ? 31, ? 32, ? 33, ? 34, ? 35, ? 36
part E pins: ? 1, ? 2, ? 3, ? 4, ? 5, ? 6, ? 7, ? 8
part F pins: ? 1, ? 2, ? 3, ? 4, ? 5, ? 6, ? 7, ? 8
part G pins: ? 1, ? 2, ? 3, ? 4, ? 5, ? 6, ? 7, ? 8, ? 9, ? 10
part A text: Цепь; NC; IOREF; RESET; 3.3V; 5V; GND; VIN
part B text: Цепь; A0/PF0/ADC0; A1/PF1/ADC1; A2/PF2/ADC2; A3/PF3/ADC3; A4/PF4/ADC4/TCK; A5/PF5/ADC5/TMS; A6/PF6/ADC6/TDO; A7/PF7/ADC7/TDI
part C text: Цепь; A8/PK0/ADC8/PCINT16; A9/PK1/ADC9/PCINT17; A10/PK2/ADC10/PCINT18; A11/PK3/ADC11/PCINT19; A12/PK4/ADC12/PCINT20; A13/PK5/ADC13/PCINT21; A14/PK6/ADC14/PCINT22; A15/PK7/ADC15/PCINT23
part D text: Цепь; +5V; 22/PA0/AD0; 23/PA1/AD1; 24/PA2/AD2; 25/PA3/AD3; 26/PA4/AD4; 27/PA5/AD5; 28/PA6/AD6; 29/PA7/AD7; 30/PC7/AD15; 31/PC6/AD14; 32/PC5/AD13; 33/PC4/AD12; 34/PC3/AD11; 35/PC2/AD10; 36/PC1/AD9; 37/PC0/AD8; 38/PD7/T0; 39/PG2/ALE; 40/PG1/RD; 41/PG0/WR; 42/PL7; 43/PL6; 44/PL5/OC5C; 45/PL4/OC5B; 46/PL3/OC5A; 47/PL2/T5; 48/PL1/ICP5; 49/PL0/ICP4; 50/PB3/MISO/PCINT3; 51/PB2/MOSI/PCINT2; 52/PB1/SCK/PCINT1; 53/PB0/SS/PCINT0; GND
part E text: Цепь; PCINT10/TXD3/PJ1/14; PCINT9/RXD3/PJ0/15; TXD2/PH1/16; RXD2/PH0/17; INT3/TXD1/PD3/; INT2/RXD1/PD2/19; INT1/SDA/PD1/20; INT0/SCL/PD0/21
part F text: Цепь; OC4B/PH4/7; OC4A/PH3/6; AIN1/OC3A/PE3/5; OC0B/PG5/4; INT5/OC3C/PE5/3; INT4/OC3B/PE4/2; TXD0/PE1/1; PCINT8/RXD0/PE0/
part G text: Цепь; SCL; SDA; AREF; GND; PCINT7/OC1C/OC0A/PB7/13; PCINT6/OC1B/PB6/12; PCINT5/OC1A/PB5/11; PCINT4/OC2A/PB4/10; OC2B/PH6/9; OC4C/PH5/8

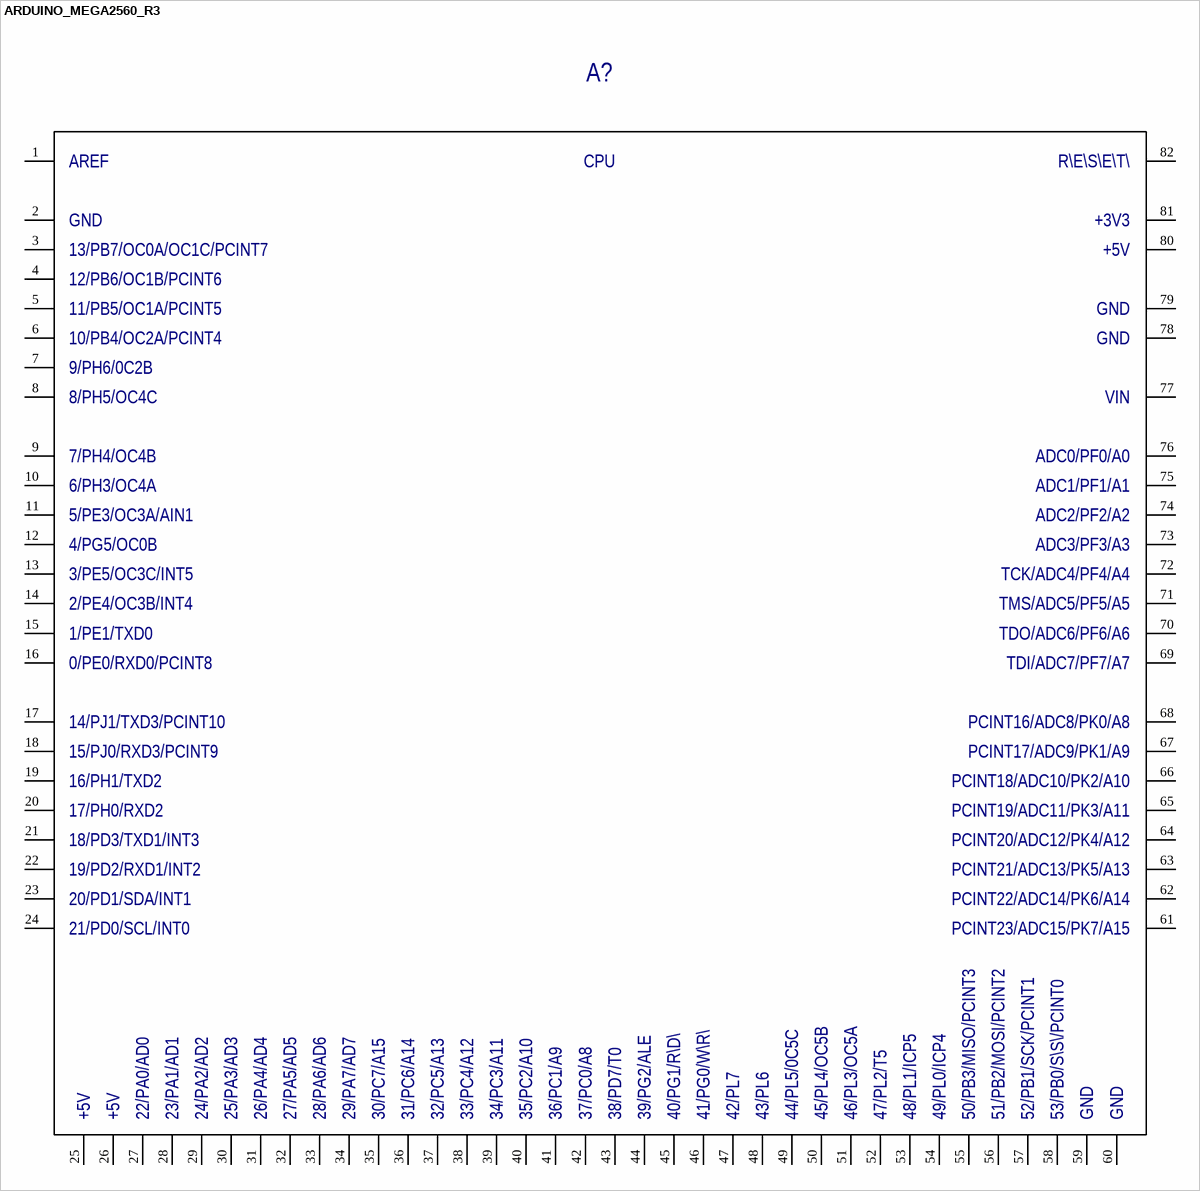
[diagram p9: symbol ARDUINO_MEGA2560_R3]

## ARDUINO_MEGA2560_R3
designator A?  (value not drawn)
Group: Group; Type: Type; TU: TU
pins: 1, 2, 3, 4, 5, 6, 7, 8, 9, 10, 11, 12, 13, 14, 15, 16, 17, 18, 19, 20, 21, 22, 23, 24, 25, 26, 27, 28, 29, 30, 31, 32, 33, 34, 35, 36, 37, 38, 39, 40, 41, 42, 43, 44, 45, 46, 47, 48, 49, 50, 51, 52, 53, 54, 55, 56, 57, 58, 59, 60, 61, 62, 63, 64, 65, 66, 67, 68, 69, 70, 71, 72, 73, 74, 75, 76, 77, 78, 79, 80, 81, 82
text: AREF; CPU; R\E\S\E\T\; GND; +3V3; 13/PB7/OC0A/OC1C/PCINT7; +5V; 12/PB6/OC1B/PCINT6; 11/PB5/OC1A/PCINT5; 10/PB4/OC2A/PCINT4; 9/PH6/0C2B; 8/PH5/OC4C; VIN; 7/PH4/OC4B; ADC0/PF0/A0; 6/PH3/OC4A; ADC1/PF1/A1; 5/PE3/OC3A/AIN1; ADC2/PF2/A2; 4/PG5/OC0B; ADC3/PF3/A3; 3/PE5/OC3C/INT5; TCK/ADC4/PF4/A4; 2/PE4/OC3B/INT4; TMS/ADC5/PF5/A5; 1/PE1/TXD0; TDO/ADC6/PF6/A6; 0/PE0/RXD0/PCINT8; TDI/ADC7/PF7/A7; 14/PJ1/TXD3/PCINT10; PCINT16/ADC8/PK0/A8; 15/PJ0/RXD3/PCINT9; PCINT17/ADC9/PK1/A9; 16/PH1/TXD2; PCINT18/ADC10/PK2/A10; 17/PH0/RXD2; PCINT19/ADC11/PK3/A11; 18/PD3/TXD1/INT3; PCINT20/ADC12/PK4/A12; 19/PD2/RXD1/INT2; PCINT21/ADC13/PK5/A13; 20/PD1/SDA/INT1; PCINT22/ADC14/PK6/A14; 21/PD0/SCL/INT0; PCINT23/ADC15/PK7/A15; 22/PA0/AD0; 23/PA1/AD1; 24/PA2/AD2; 25/PA3/AD3; 26/PA4/AD4; 27/PA5/AD5; 28/PA6/AD6; 29/PA7/AD7; 30/PC7/A15; 31/PC6/A14; 32/PC5/A13; 33/PC4/A12; 34/PC3/A11; 35/PC2/A10; 36/PC1/A9; 37/PC0/A8; 38/PD7/T0; 39/PG2/ALE; 40/PG1/R\D\; 41/PG0/W\R\; 42/PL7; 43/PL6; 44/PL5/0C5C; 45/PL4/OC5B; 46/PL3/OC5A; 47/PL2/T5; 48/PL1/ICP5; 49/PL0/ICP4; 50/PB3/MISO/PCINT3; 51/PB2/MOSI/PCINT2; 52/PB1/SCK/PCINT1; 53/PB0/S\S\/PCINT0

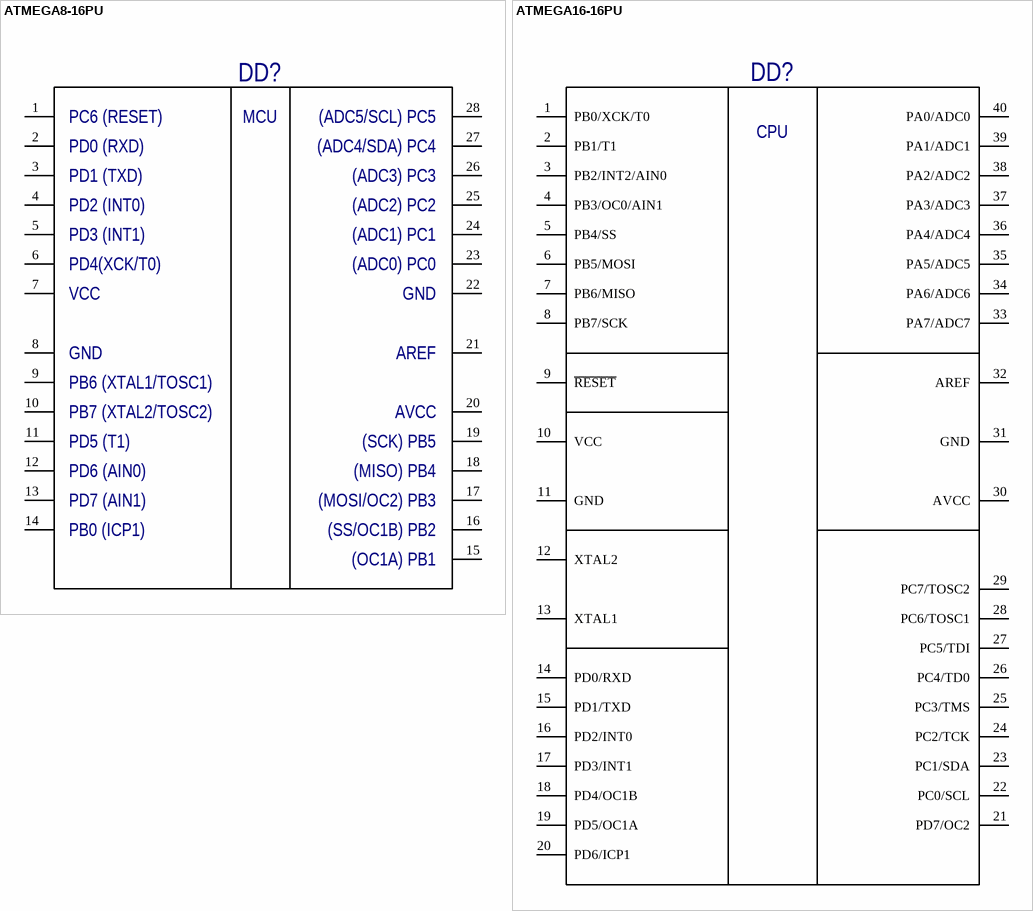
[diagram p10: symbols ATMEGA8-16PU to ATMEGA16-16PU]

## ATMEGA8-16PU
designator DD?  (value not drawn)
Group: Микросхемы; Type: Type; TU: TU
pins: 1, 2, 3, 4, 5, 6, 7, 8, 9, 10, 11, 12, 13, 14, 15, 16, 17, 18, 19, 20, 21, 22, 23, 24, 25, 26, 27, 28
text: PC6 (RESET); MCU; (ADC5/SCL) PC5; PD0 (RXD); (ADC4/SDA) PC4; PD1 (TXD); (ADC3) PC3; PD2 (INT0); (ADC2) PC2; PD3 (INT1); (ADC1) PC1; PD4(XCK/T0); (ADC0) PC0; VCC; GND; AREF; PB6 (XTAL1/TOSC1); PB7 (XTAL2/TOSC2); AVCC; PD5 (T1); (SCK) PB5; PD6 (AIN0); (MISO) PB4; PD7 (AIN1); (MOSI/OC2) PB3; PB0 (ICP1); (SS/OC1B) PB2; (OC1A) PB1

## ATMEGA16-16PU
designator DD?  (value not drawn)
Group: Микросхемы; Type: Type; TU: TU
footprint DIP40
pins: 1 PB0/XCK/T0, 2 PB1/T1, 3 PB2/INT2/AIN0, 4 PB3/OC0/AIN1, 5 PB4/SS, 6 PB5/MOSI, 7 PB6/MISO, 8 PB7/SCK, 9 ~{RESET}, 10 VCC (power), 11 GND (power), 12 XTAL2, 13 XTAL1, 14 PD0/RXD, 15 PD1/TXD, 16 PD2/INT0, 17 PD3/INT1, 18 PD4/OC1B, 19 PD5/OC1A, 20 PD6/ICP1, 21 PD7/OC2, 22 PC0/SCL, 23 PC1/SDA, 24 PC2/TCK, 25 PC3/TMS, 26 PC4/TD0, 27 PC5/TDI, 28 PC6/TOSC1, 29 PC7/TOSC2, 30 AVCC (power), 31 GND (power), 32 AREF (power), 33 PA7/ADC7, 34 PA6/ADC6, 35 PA5/ADC5, 36 PA4/ADC4, 37 PA3/ADC3, 38 PA2/ADC2, 39 PA1/ADC1, 40 PA0/ADC0
text: CPU

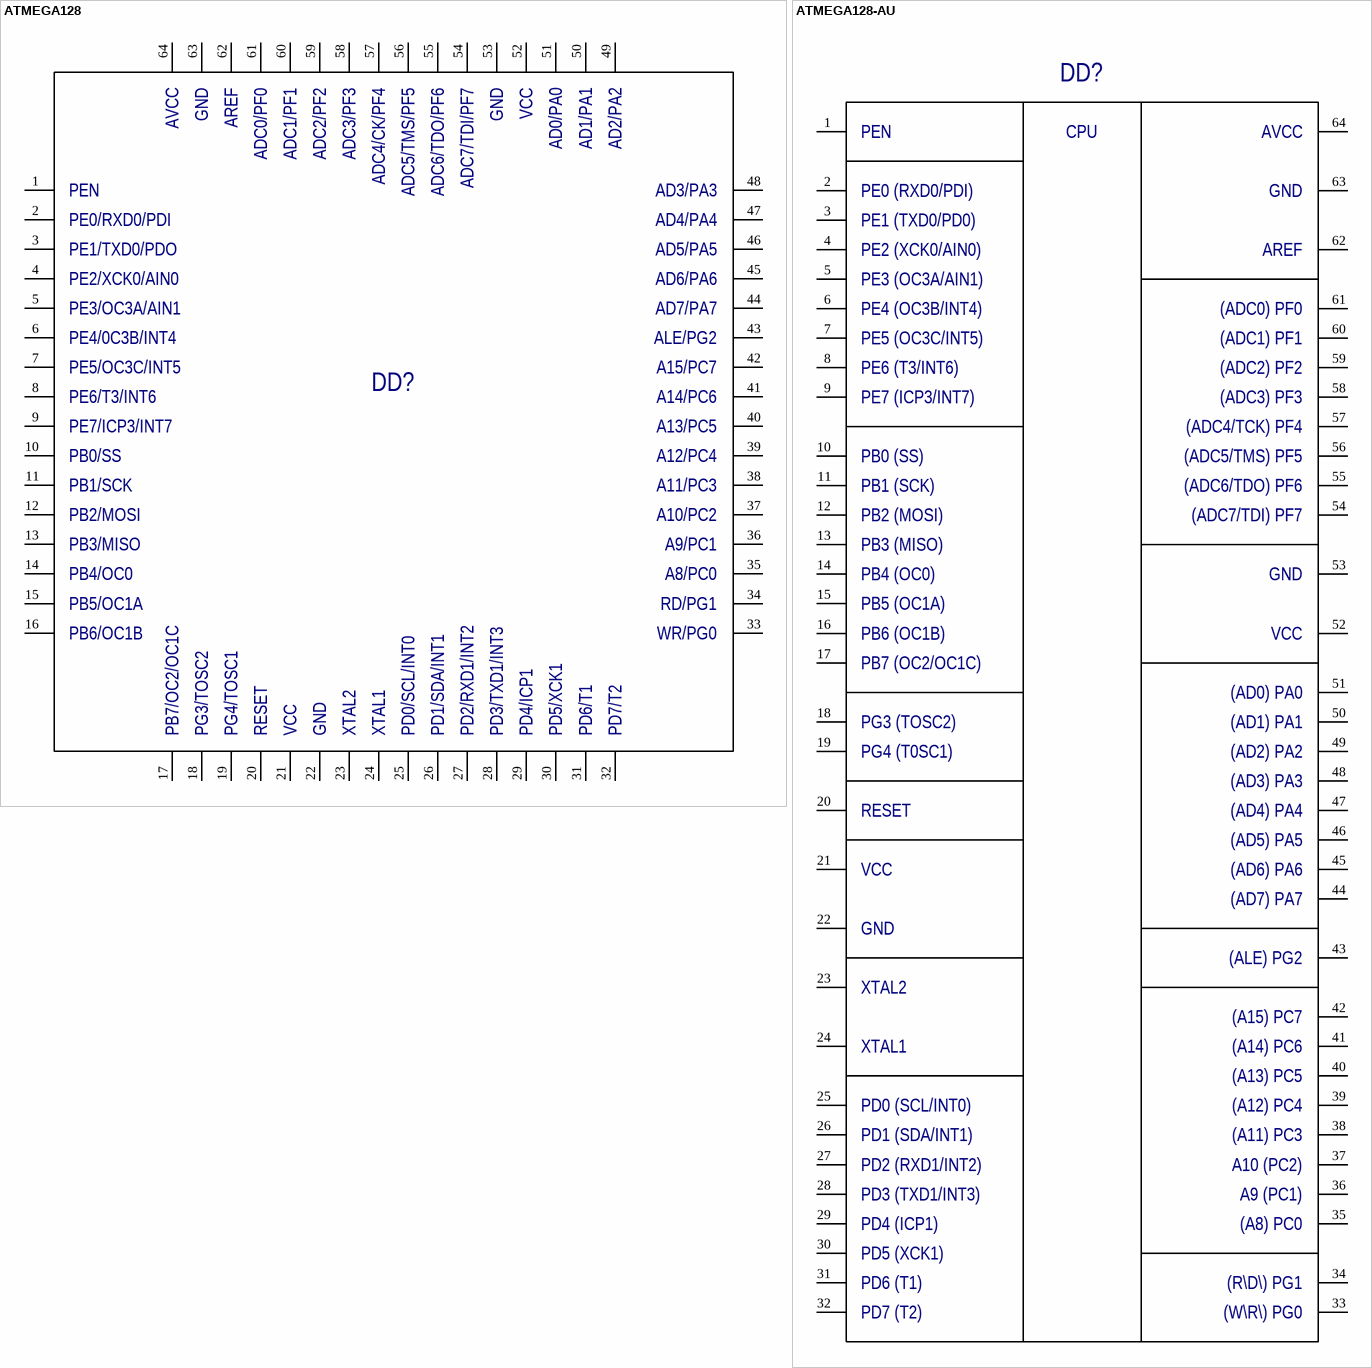
[diagram p11: symbols ATMEGA128 to ATMEGA128-AU]

## ATMEGA128
designator DD?  (value not drawn)
Group: Микросхемы; Type: Type; TU: TU
pins: 1, 2, 3, 4, 5, 6, 7, 8, 9, 10, 11, 12, 13, 14, 15, 16, 17, 18, 19, 20, 21, 22, 23, 24, 25, 26, 27, 28, 29, 30, 31, 32, 33, 34, 35, 36, 37, 38, 39, 40, 41, 42, 43, 44, 45, 46, 47, 48, 49, 50, 51, 52, 53, 54, 55, 56, 57, 58, 59, 60, 61, 62, 63, 64
text: AVCC; GND; AREF; ADC0/PF0; ADC1/PF1; ADC2/PF2; ADC3/PF3; ADC4/CK/PF4; ADC5/TMS/PF5; ADC6/TDO/PF6; ADC7/TDI/PF7; VCC; AD0/PA0; AD1/PA1; AD2/PA2; PEN; AD3/PA3; PE0/RXD0/PDI; AD4/PA4; PE1/TXD0/PDO; AD5/PA5; PE2/XCK0/AIN0; AD6/PA6; PE3/OC3A/AIN1; AD7/PA7; PE4/0C3B/INT4; ALE/PG2; PE5/OC3C/INT5; A15/PC7; PE6/T3/INT6; A14/PC6; PE7/ICP3/INT7; A13/PC5; PB0/SS; A12/PC4; PB1/SCK; A11/PC3; PB2/MOSI; A10/PC2; PB3/MISO; A9/PC1; PB4/OC0; A8/PC0; PB5/OC1A; RD/PG1; PB6/OC1B; WR/PG0; PB7/OC2/OC1C; PG3/TOSC2; PG4/TOSC1; RESET; XTAL2; XTAL1; PD0/SCL/INT0; PD1/SDA/INT1; PD2/RXD1/INT2; PD3/TXD1/INT3; PD4/ICP1; PD5/XCK1; PD6/T1; PD7/T2

## ATMEGA128-AU
designator DD?  (value not drawn)
Group: Микросхемы; Type: Type; TU: TU
footprint TQFP-64
pins: 1, 2, 3, 4, 5, 6, 7, 8, 9, 10, 11, 12, 13, 14, 15, 16, 17, 18, 19, 20, 21, 22, 23, 24, 25, 26, 27, 28, 29, 30, 31, 32, 33, 34, 35, 36, 37, 38, 39, 40, 41, 42, 43, 44, 45, 46, 47, 48, 49, 50, 51, 52, 53, 54, 55, 56, 57, 58, 59, 60, 61, 62, 63, 64
text: PEN; CPU; AVCC; PE0 (RXD0/PDI); GND; PE1 (TXD0/PD0); PE2 (XCK0/AIN0); AREF; PE3 (OC3A/AIN1); PE4 (OC3B/INT4); (ADC0) PF0; PE5 (OC3C/INT5); (ADC1) PF1; PE6 (T3/INT6); (ADC2) PF2; PE7 (ICP3/INT7); (ADC3) PF3; (ADC4/TCK) PF4; PB0 (SS); (ADC5/TMS) PF5; PB1 (SCK); (ADC6/TDO) PF6; PB2 (MOSI); (ADC7/TDI) PF7; PB3 (MISO); PB4 (OC0); PB5 (OC1A); PB6 (OC1B); VCC; PB7 (OC2/OC1C); (AD0) PA0; PG3 (TOSC2); (AD1) PA1; PG4 (T0SC1); (AD2) PA2; (AD3) PA3; RESET; (AD4) PA4; (AD5) PA5; (AD6) PA6; (AD7) PA7; (ALE) PG2; XTAL2; (A15) PC7; XTAL1; (A14) PC6; (A13) PC5; PD0 (SCL/INT0); (A12) PC4; PD1 (SDA/INT1); (A11) PC3; PD2 (RXD1/INT2); A10 (PC2); PD3 (TXD1/INT3); A9 (PC1); PD4 (ICP1); (A8) PC0; PD5 (XCK1); PD6 (T1); (R\D\) PG1; PD7 (T2); (W\R\) PG0

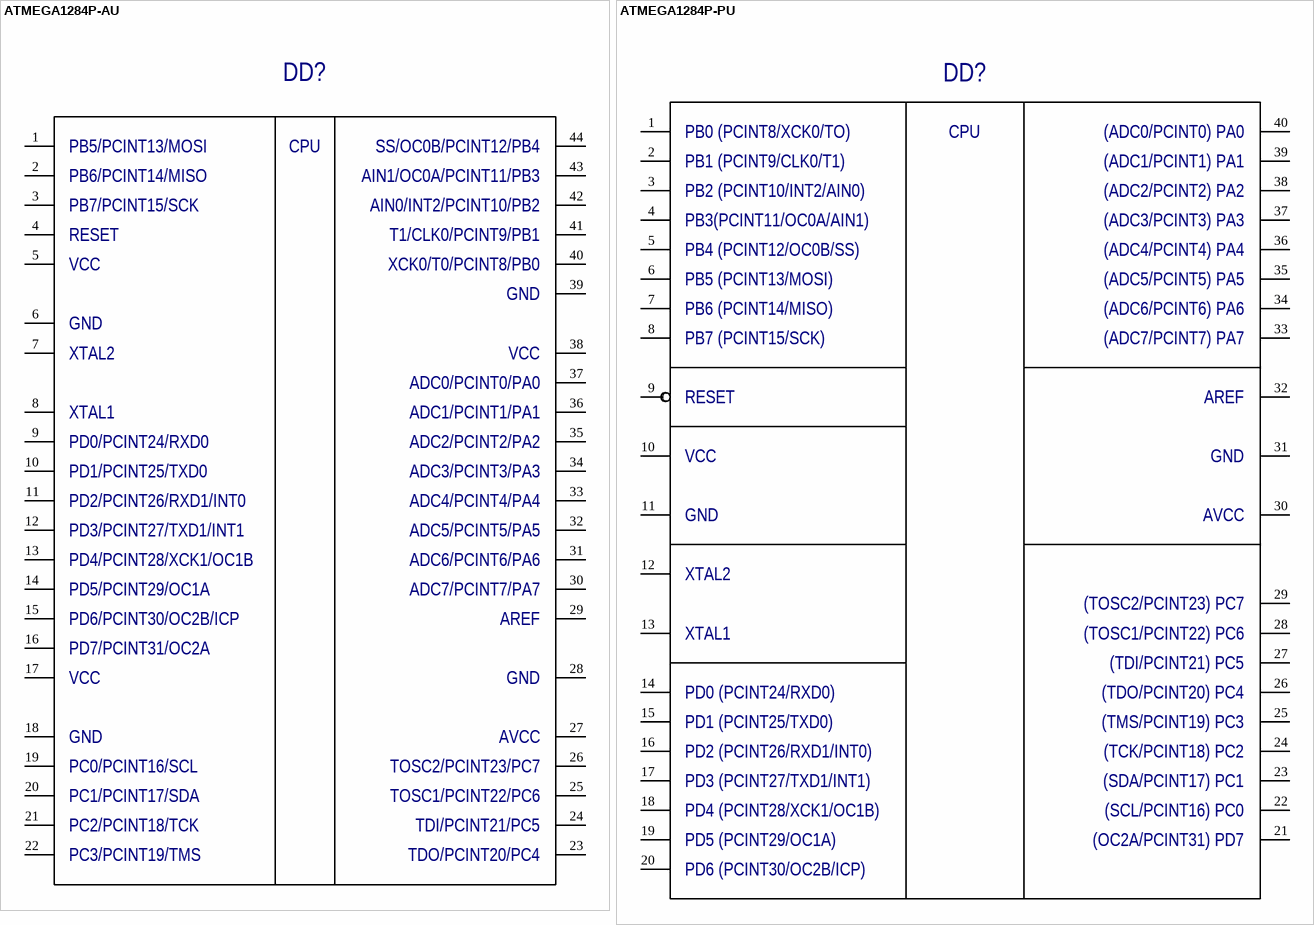
[diagram p12: symbols ATMEGA1284P-AU to ATMEGA1284P-PU]

## ATMEGA1284P-AU
designator DD?  (value not drawn)
Group: Микросхемы; Type: Type; TU: TU
pins: 1, 2, 3, 4, 5, 6, 7, 8, 9, 10, 11, 12, 13, 14, 15, 16, 17, 18, 19, 20, 21, 22, 23, 24, 25, 26, 27, 28, 29, 30, 31, 32, 33, 34, 35, 36, 37, 38, 39, 40, 41, 42, 43, 44
text: PB5/PCINT13/MOSI; CPU; SS/OC0B/PCINT12/PB4; PB6/PCINT14/MISO; AIN1/OC0A/PCINT11/PB3; PB7/PCINT15/SCK; AIN0/INT2/PCINT10/PB2; RESET; T1/CLK0/PCINT9/PB1; VCC; XCK0/T0/PCINT8/PB0; GND; XTAL2; ADC0/PCINT0/PA0; XTAL1; ADC1/PCINT1/PA1; PD0/PCINT24/RXD0; ADC2/PCINT2/PA2; PD1/PCINT25/TXD0; ADC3/PCINT3/PA3; PD2/PCINT26/RXD1/INT0; ADC4/PCINT4/PA4; PD3/PCINT27/TXD1/INT1; ADC5/PCINT5/PA5; PD4/PCINT28/XCK1/OC1B; ADC6/PCINT6/PA6; PD5/PCINT29/OC1A; ADC7/PCINT7/PA7; PD6/PCINT30/OC2B/ICP; AREF; PD7/PCINT31/OC2A; AVCC; PC0/PCINT16/SCL; TOSC2/PCINT23/PC7; PC1/PCINT17/SDA; TOSC1/PCINT22/PC6; PC2/PCINT18/TCK; TDI/PCINT21/PC5; PC3/PCINT19/TMS; TDO/PCINT20/PC4

## ATMEGA1284P-PU
designator DD?  (value not drawn)
Group: Микросхемы; Type: Type; TU: TU
footprint DIP40
pins: 1, 2, 3, 4, 5, 6, 7, 8, 9, 10, 11, 12, 13, 14, 15, 16, 17, 18, 19, 20, 21, 22, 23, 24, 25, 26, 27, 28, 29, 30, 31, 32, 33, 34, 35, 36, 37, 38, 39, 40
text: PB0 (PCINT8/XCK0/TO); CPU; (ADC0/PCINT0) PA0; PB1 (PCINT9/CLK0/T1); (ADC1/PCINT1) PA1; PB2 (PCINT10/INT2/AIN0); (ADC2/PCINT2) PA2; PB3(PCINT11/OC0A/AIN1); (ADC3/PCINT3) PA3; PB4 (PCINT12/OC0B/SS); (ADC4/PCINT4) PA4; PB5 (PCINT13/MOSI); (ADC5/PCINT5) PA5; PB6 (PCINT14/MISO); (ADC6/PCINT6) PA6; PB7 (PCINT15/SCK); (ADC7/PCINT7) PA7; RESET; AREF; VCC; GND; AVCC; XTAL2; (TOSC2/PCINT23) PC7; XTAL1; (TOSC1/PCINT22) PC6; (TDI/PCINT21) PC5; PD0 (PCINT24/RXD0); (TDO/PCINT20) PC4; PD1 (PCINT25/TXD0); (TMS/PCINT19) PC3; PD2 (PCINT26/RXD1/INT0); (TCK/PCINT18) PC2; PD3 (PCINT27/TXD1/INT1); (SDA/PCINT17) PC1; PD4 (PCINT28/XCK1/OC1B); (SCL/PCINT16) PC0; PD5 (PCINT29/OC1A); (OC2A/PCINT31) PD7; PD6 (PCINT30/OC2B/ICP)

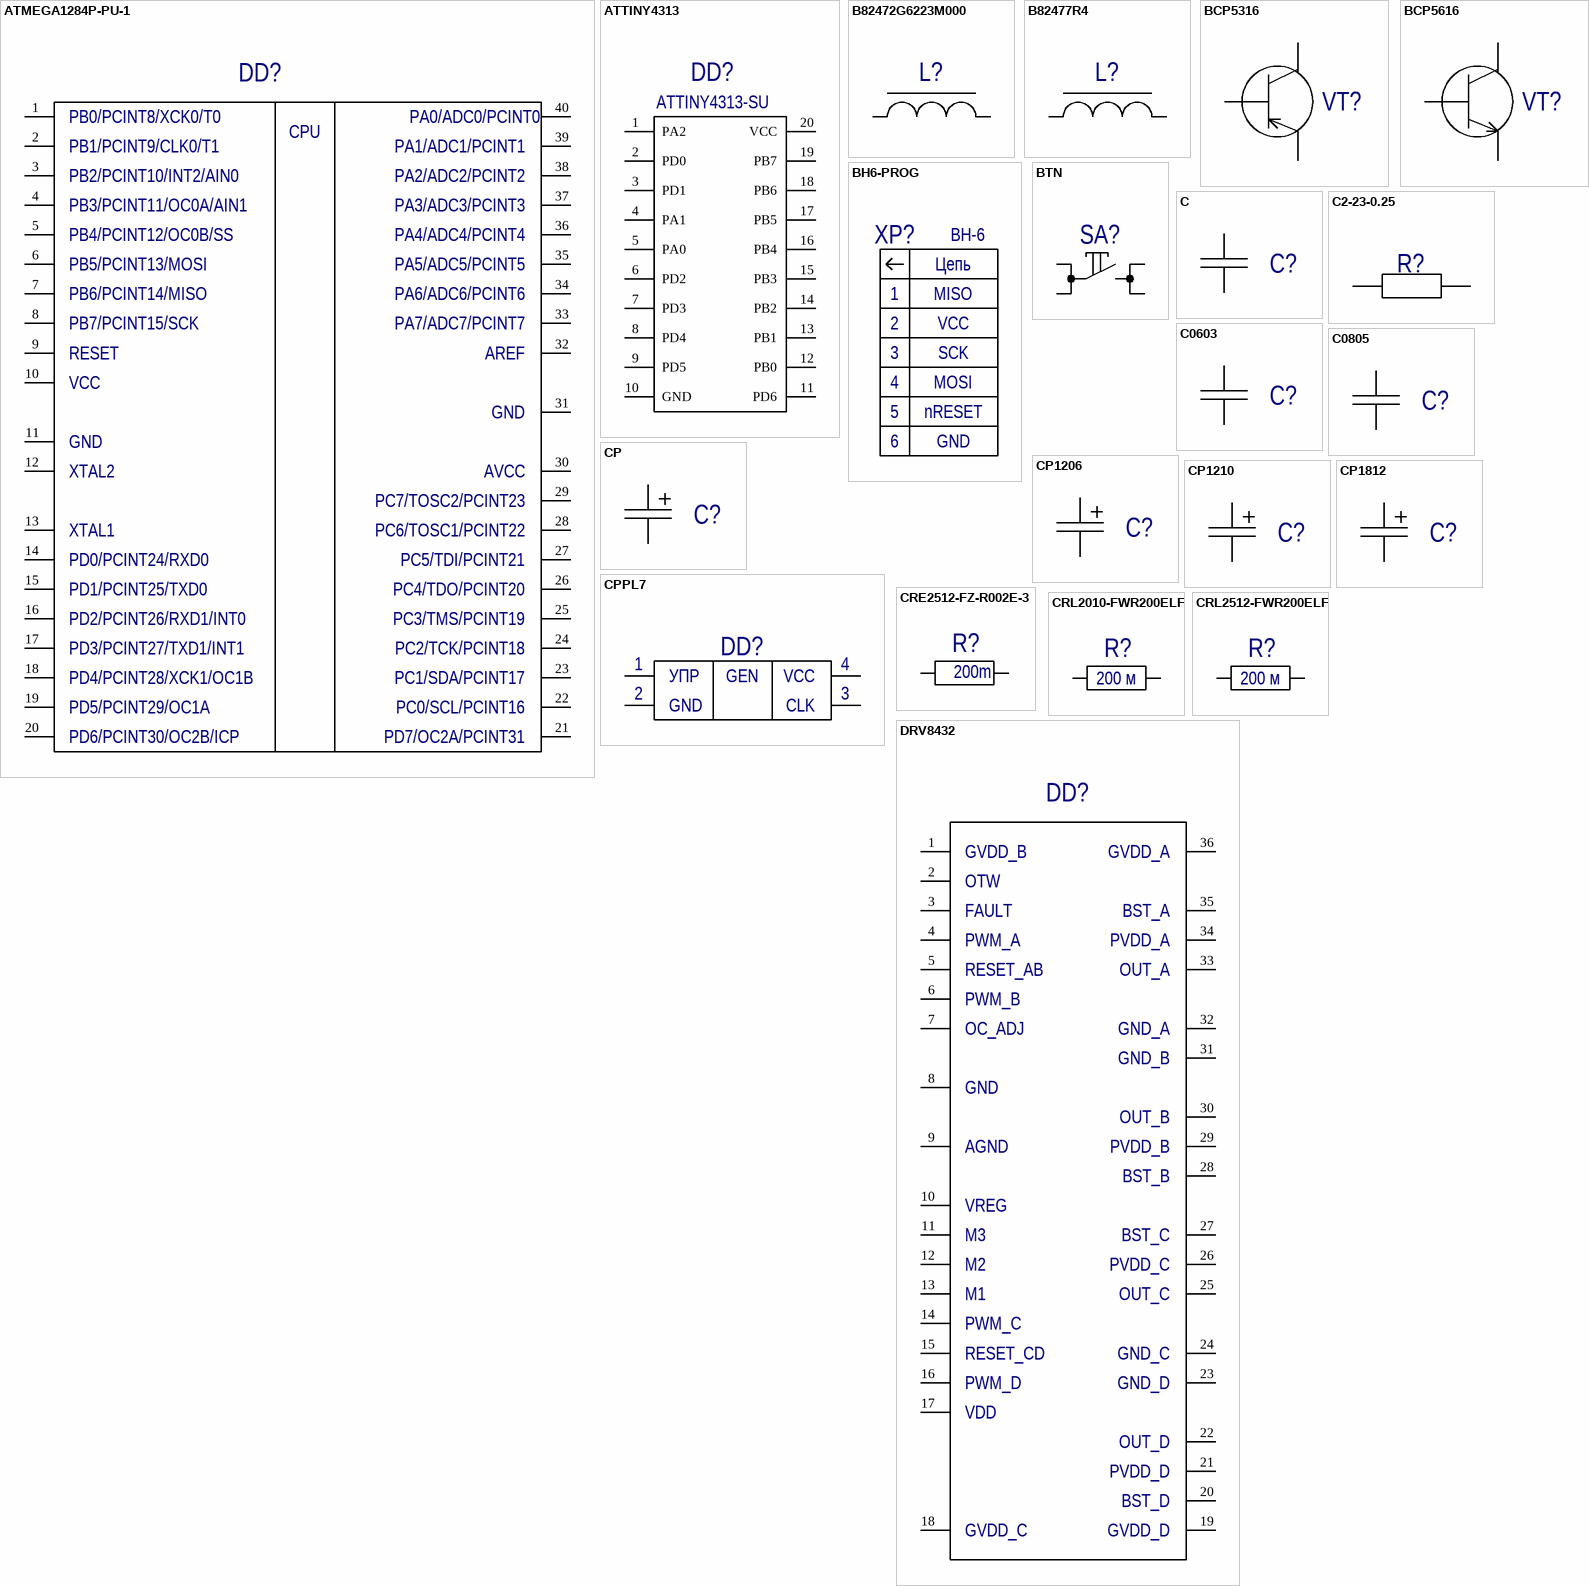
[diagram p13: symbols ATMEGA1284P-PU-1 to DRV8432]

## ATMEGA1284P-PU-1
designator DD?  (value not drawn)
Group: Микросхемы; Type: Type; TU: TU
footprint DIP40
pins: 1, 2, 3, 4, 5, 6, 7, 8, 9, 10, 11, 12, 13, 14, 15, 16, 17, 18, 19, 20, 21, 22, 23, 24, 25, 26, 27, 28, 29, 30, 31, 32, 33, 34, 35, 36, 37, 38, 39, 40
text: PB0/PCINT8/XCK0/T0; PA0/ADC0/PCINT0; CPU; PB1/PCINT9/CLK0/T1; PA1/ADC1/PCINT1; PB2/PCINT10/INT2/AIN0; PA2/ADC2/PCINT2; PB3/PCINT11/OC0A/AIN1; PA3/ADC3/PCINT3; PB4/PCINT12/OC0B/SS; PA4/ADC4/PCINT4; PB5/PCINT13/MOSI; PA5/ADC5/PCINT5; PB6/PCINT14/MISO; PA6/ADC6/PCINT6; PB7/PCINT15/SCK; PA7/ADC7/PCINT7; RESET; AREF; VCC; GND; XTAL2; AVCC; PC7/TOSC2/PCINT23; XTAL1; PC6/TOSC1/PCINT22; PD0/PCINT24/RXD0; PC5/TDI/PCINT21; PD1/PCINT25/TXD0; PC4/TDO/PCINT20; PD2/PCINT26/RXD1/INT0; PC3/TMS/PCINT19; PD3/PCINT27/TXD1/INT1; PC2/TCK/PCINT18; PD4/PCINT28/XCK1/OC1B; PC1/SDA/PCINT17; PD5/PCINT29/OC1A; PC0/SCL/PCINT16; PD6/PCINT30/OC2B/ICP; PD7/OC2A/PCINT31

## ATTINY4313
designator DD?  Type: ATTINY4313-SU  (hidden comment: ATTINY4313)
Микроконтроллер ARM CortexM3; Manufacturer: Atmel; Group: Микросхемы; Price: 100
pins: 1 PA2, 2 PD0, 3 PD1, 4 PA1, 5 PA0, 6 PD2, 7 PD3, 8 PD4, 9 PD5, 10 GND, 11 PD6, 12 PB0, 13 PB1, 14 PB2, 15 PB3, 16 PB4, 17 PB5, 18 PB6, 19 PB7, 20 VCC

## B82472G6223M000
designator L?  (value not drawn)
ЧИП-индуктивность силовая проволочная экранированная 22мкГн +20% 100кГц феррит 1.45А 91мОм; Value: 22uH; Group: Group; Type: Type; TU: TU; FullName: B82472G6223M000; Part Number: B82472G6223M000
pins: 1 0, 2 1

## B82477R4
designator L?  (value not drawn)
Group: Group; Type: Type; TU: TU; Value: Value
footprint B82477R4
pins: 1, 2

## BCP5316
designator VT?  (value not drawn)
Транзистор pnp so-t223 80V, 1A; Group: Транзисторы; Type: Type; TU: TU; Part Number: BCP5316
pins: 1 0, 2 0, 3 1

## BCP5616
designator VT?  (value not drawn)
Транзистор npn sot-223, 80V, 1A; Group: Транзисторы; Type: Type; TU: TU; Part Number: BCP5616
pins: 1 0, 2 0, 3 1

## BH6-PROG
designator XP?  Type: BH-6  (hidden comment: BH6-PROG)
Group: Соединители; FullName: Вилка BH-6; Price: 10
pins: 1, 2, 3, 4, 5, 6
text: Цепь; MISO; VCC; SCK; MOSI; nRESET; GND

## BTN
designator SA?, comment Кнопка  (value not drawn)
Group: Кнопки; Type: Type; TU: TU
pins: 1, 2, 3, 4

## C
designator C?  (value not drawn)
Group: Конденсаторы; Type: Type; TU: TU; Value: Value; Volt: Volt; TKE: TKE; Precision: Precision
pins: 1 0, 2 1

## C2-23-0.25
designator R?  (value not drawn)
Group: Резисторы; Type: Type; TU: TU; Power: Power; Precision: Precision
footprint C2-23-0.25
pins: 1, 2

## C0603
designator C?  (value not drawn)
Group: Конденсаторы; Type: Type; TU: TU; Value: Value; Volt: Volt; TKE: TKE; Precision: Precision
footprint C0603
pins: 1, 2

## C0805
designator C?  (value not drawn)
Group: Конденсаторы; Type: Type; TU: TU; Value: Value; Volt: Volt; TKE: TKE; Precision: Precision
footprint C0805
pins: 1 0, 2 1

## CP
designator C?  (value not drawn)
Group: Конденсаторы; Type: Type; TU: TU; Value: Value; Volt: Volt; TKE: TKE; Precision: Precision
pins: 1, 2

## CP1206
designator C?  (value not drawn)
Group: Конденсаторы; Type: Type; TU: TU; Value: Value; Volt: Volt; TKE: TKE; Precision: Precision
footprint C1206
pins: 1, 2

## CP1210
designator C?  (value not drawn)
Group: Конденсаторы; Type: Type; TU: TU; Value: Value; Volt: Volt; TKE: TKE; Precision: Precision
footprint C1210
pins: 1, 2

## CP1812
designator C?  (value not drawn)
Group: Group; Type: Type; TU: TU; Value: Value; Volt: Volt; TKE: TKE; Precision: Precision
pins: 1, 2

## CPPL7
designator DD?  (value not drawn)
Group: Микросхемы; Type: Type; TU: TU
pins: 1, 4, 5, 8
text: УПР; GEN; VCC; 2; GND; CLK; 3

## CRE2512-FZ-R002E-3
designator R?  value 200m
Резистор шунт BOURNS 2512 3W 1% 200 мОм; Part Number: CRE2512-FZ-R002E-3; Group: Резисторы; Type: Type; TU: TU; Precision: 1%; Manufacturer: BOURNS
pins: 1, 2

## CRL2010-FWR200ELF
designator R?  value 200 м
Резистор шунт BOURNS 0.5W 1% 200 мОм; Part Number: CRL2010-FWR200ELF; Group: Резисторы; Type: Type; TU: TU; Precision: 1%; Manufacturer: BOURNS
pins: 1, 2

## CRL2512-FWR200ELF
designator R?  value 200 м
Резистор шунт BOURNS 1W 1% 200 мОм; Part Number: CRL2512-FWR200ELF; Group: Резисторы; Type: Type; TU: TU; Precision: 1%; Manufacturer: BOURNS
pins: 1, 2

## DRV8432
designator DD?  (value not drawn)
Group: Микросхемы; Type: Type; TU: TU
footprint DKD
pins: 1, 2, 3, 4, 5, 6, 7, 8, 9, 10, 11, 12, 13, 14, 15, 16, 17, 18, 19, 20, 21, 22, 23, 24, 25, 26, 27, 28, 29, 30, 31, 32, 33, 34, 35, 36
text: GVDD_B; GVDD_A; OTW; FAULT; BST_A; PWM_A; PVDD_A; RESET_AB; OUT_A; PWM_B; OC_ADJ; GND_A; GND_B; GND; OUT_B; AGND; PVDD_B; BST_B; VREG; M3; BST_C; M2; PVDD_C; M1; OUT_C; PWM_C; RESET_CD; GND_C; PWM_D; GND_D; VDD; OUT_D; PVDD_D; BST_D; GVDD_C; GVDD_D

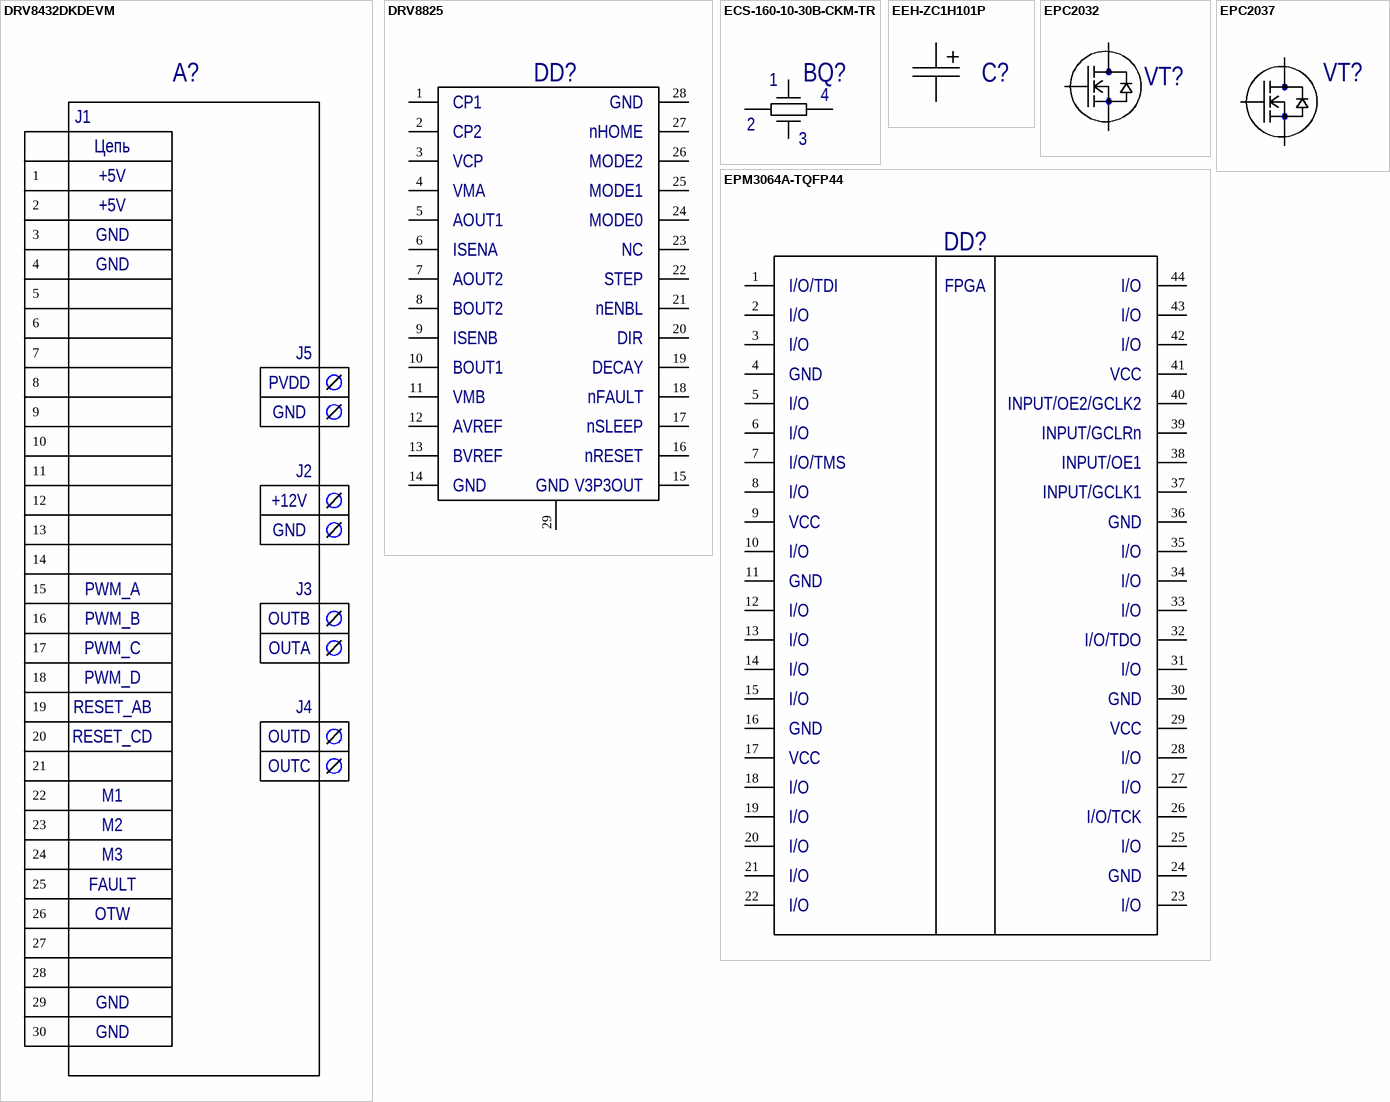
[diagram p14: symbols DRV8432DKDEVM to EPM3064A-TQFP44]

## DRV8432DKDEVM
designator A?  (value not drawn)
Модуль силовой; Manufacturer: Texas Instruments; Price: 7000; Type: Модуль силовой DRV8432DKDEVM
pins: 1, 2, 3, 4, 5, 6, 7, 8, 9, 10, 11, 12, 13, 14, 15, 16, 17, 18, 19, 20, 21, 22, 23, 24, 25, 26, 27, 28, 29, 30, 31, 32, 32, 33, 33, 34, 34, 35
text: J1; Цепь; +5V; GND; J5; PVDD; J2; +12V; PWM_A; J3; PWM_B; OUTB; PWM_C; OUTA; PWM_D; RESET_AB; J4; RESET_CD; OUTD; OUTC; M1; M2; M3; FAULT; OTW

## DRV8825
designator DD?  (value not drawn)
DRV8825 Stepper Motor Controller IC; Manufacturer: Texas Instruments; Group: Микросхемы; FullName: DRV8825PWP; Type: Type; TU: TU; Part Number: DRV8825PWP
footprint TSOP65P640X120_HS-29N (TSOP, 28-Leads, Body 9,70x4,40mm, Pitch 0,65mm, Thermal Pad 5,18x3,10mm, IPC Medium Density)
pins: 1, 2, 3, 4, 5, 6, 7, 8, 9, 10, 11, 12, 13, 14, 15, 16, 17, 18 REFIN2+/AUN4+, 19, 20, 21, 22, 23, 24, 25, 26, 27, 28, 29
text: CP1; GND; CP2; nHOME; VCP; MODE2; VMA; MODE1; AOUT1; MODE0; ISENA; NC; AOUT2; STEP; BOUT2; nENBL; ISENB; DIR; BOUT1; DECAY; VMB; nFAULT; AVREF; nSLEEP; BVREF; nRESET; V3P3OUT

## ECS-160-10-30B-CKM-TR
designator BQ?
Резонатор кварцевый, 16М; Part Number: ECS-160-10-30B-CKM-TR; Group: Group; Type: Type; TU: TU
pins: 1 0, 1 0, 1 0, 2 0
text: 4; 3

## EEH-ZC1H101P
designator C?, comment CP1206  (value not drawn)
Конденсатор электролитический Panasonic 100uF, 50V, 20%; Part Number: EEH-ZC1H101P; Group: Конденсаторы; Value: 100u; Type: Type; TU: TU; Volt: 50V; TKE: TKE; Precision: 20%; Manufacturer: Panasonic
pins: 1, 2

## EPC2032
designator VT?  (value not drawn)
100V, 4мОм, 48А; Group: Транзисторы; Type: Type; TU: TU; Part Number: EPC2032
pins: 1 0, 2 0, 3 1

## EPC2037
designator VT?, comment 7  (value not drawn)
100V, 550мОм, 1,7А; Part Number: EPC2037; Group: Транзисторы; Type: Type; TU: TU
pins: 1 0, 2 0, 3 1

## EPM3064A-TQFP44
designator DD?  (value not drawn)
Group: Микросхемы; Type: Type; TU: TU
pins: 1, 2, 3, 4, 5, 6, 7, 8, 9, 10, 11, 12, 13, 14, 15, 16, 17, 18, 19, 20, 21, 22, 23, 24, 25, 26, 27, 28, 29, 30, 31, 32, 33, 34, 35, 36, 37, 38, 39, 40, 41, 42, 43, 44
text: I/O/TDI; FPGA; I/O; GND; VCC; INPUT/OE2/GCLK2; INPUT/GCLRn; I/O/TMS; INPUT/OE1; INPUT/GCLK1; I/O/TDO; I/O/TCK

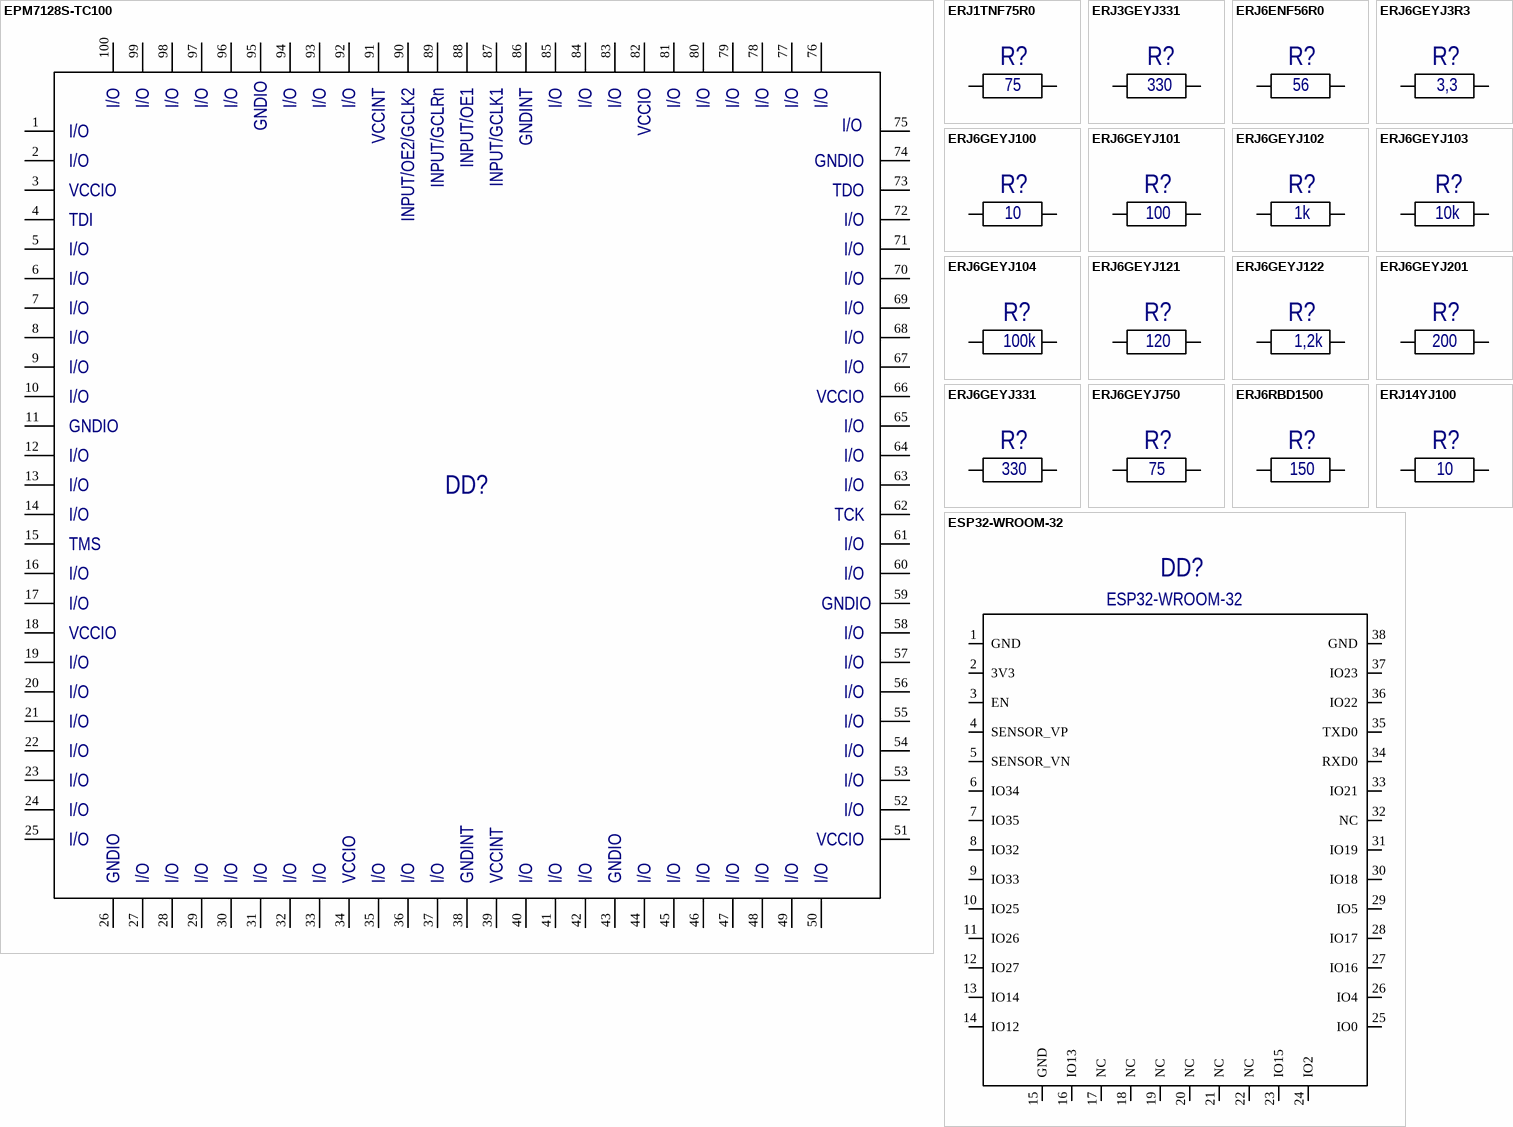
[diagram p15: symbols EPM7128S-TC100 to ESP32-WROOM-32]

## EPM7128S-TC100
designator DD?  (value not drawn)
Group: Микросхемы; Type: Type; TU: TU
pins: 1, 2, 3, 4, 5, 6, 7, 8, 9, 10, 11, 12, 13, 14, 15, 16, 17, 18, 19, 20, 21, 22, 23, 24, 25, 26, 27, 28, 29, 30, 31, 32, 33, 34, 35, 36, 37, 38, 39, 40, 41, 42, 43, 44, 45, 46, 47, 48, 49, 50, 51, 52, 53, 54, 55, 56, 57, 58, 59, 60, 61, 62, 63, 64, 65, 66, 67, 68, 69, 70, 71, 72, 73, 74, 75, 76, 77, 78, 79, 80, 81, 82, 83, 84, 85, 86, 87, 88, 89, 90, 91, 92, 93, 94, 95, 96, 97, 98, 99, 100
text: I/O; VCCINT; INPUT/OE2/GCLK2; INPUT/GCLRn; INPUT/OE1; INPUT/GCLK1; GNDINT; VCCIO; GNDIO; TDO; TDI; TCK; TMS

## ERJ1TNF75R0
designator R?  value 75
Резистор Panasonic 2512 1Вт 1% 75Ом; Part Number: Резистор 2512, 1Вт, 75Ом±1% ERJ1TNF75R0; Group: Резисторы; Power: 1W; Type: Type; TU: TU; Precision: ±1%; Manufacturer: Panasonic
pins: 1, 2

## ERJ3GEYJ331
designator R?  value 330
Резистор Panasonic 0603 5% 330Ом; Part Number: ERJ3GEYJ331; Group: Резисторы; Power: 0,125; Type: Type; TU: TU; Precision: ±5%; Manufacturer: Panasonic
pins: 1, 2

## ERJ6ENF56R0
designator R?  value 56
Резистор Panasonic 0805 1% 56Ом; Part Number: Резистор 0805, 0,125Вт, 56Ом±1% ERJ6ENF56R0; Group: Резисторы; Power: 0,125; Type: Type; TU: TU; Precision: ±1%; Manufacturer: Panasonic
pins: 1, 2

## ERJ6GEYJ3R3
designator R?  value 3,3
Резистор Panasonic 0805 5% 3.3Ом; Part Number: Резистор 0805, 0,125Вт, 10Ом±5% ERJ6GEYJ100; Group: Резисторы; Power: 0,125; Type: Type; TU: TU; Precision: ±5%; Manufacturer: Panasonic
pins: 1, 2

## ERJ6GEYJ100
designator R?  value 10
Резистор Panasonic 0805 5% 10Ом; Part Number: Резистор 0805, 0,125Вт, 10Ом±5% ERJ6GEYJ100; Group: Резисторы; Power: 0,125; Type: Type; TU: TU; Precision: ±5%; Manufacturer: Panasonic
pins: 1, 2

## ERJ6GEYJ101
designator R?  value 100
Резистор Panasonic 0805 5% 100Ом; Part Number: Резистор 0805, 0,125Вт, 100Ом±5% ERJ6GEYJ101; Group: Резисторы; Power: 0,125; Type: Type; TU: TU; Precision: ±5%; Manufacturer: Panasonic
pins: 1, 2

## ERJ6GEYJ102
designator R?  value 1k
Резистор Panasonic 0805 5% 1к; Part Number: Резистор 0805, 0,125Вт, 1кОм±5% ERJ6GEYJ102; Group: Резисторы; Power: 0,125; Type: Type; TU: TU; Precision: ±5%; Manufacturer: Panasonic
pins: 1, 2

## ERJ6GEYJ103
designator R?  value 10k
Резистор Panasonic 0805 5% 10к; Part Number: Резистор 0805, 0,125Вт, 100кОм±5% ERJ6GEYJ104; Group: Резисторы; Power: 0,125; Type: Type; TU: TU; Precision: ±5%; Manufacturer: Panasonic
pins: 1, 2

## ERJ6GEYJ104
designator R?  value 100k
Резистор Panasonic 0805 5% 100к; Part Number: Резистор 0805, 0,125Вт, 100кОм±5% ERJ6GEYJ104; Group: Резисторы; Power: 0,125; Type: Type; TU: TU; Precision: ±5%; Manufacturer: Panasonic
pins: 1, 2

## ERJ6GEYJ121
designator R?  value 120
Резистор Panasonic 0805 5% 120Ом; Part Number: Резистор 0805, 0,125Вт, 120Ом±5% ERJ6GEYJ121; Group: Резисторы; Power: 0,125; Type: Type; TU: TU; Precision: ±5%; Manufacturer: Panasonic
pins: 1, 2

## ERJ6GEYJ122
designator R?  value 1,2k
Резистор Panasonic 0805 5% 1.2к; Part Number: Резистор 0805, 0,125Вт, 1кОм±5% ERJ6GEYJ102; Group: Резисторы; Power: 0,125; Type: Type; TU: TU; Precision: ±5%; Manufacturer: Panasonic
pins: 1, 2

## ERJ6GEYJ201
designator R?  value 200
Резистор Panasonic 0805 5% 200Ом; Part Number: Резистор 0805, 0,125Вт, 20Ом±5% ERJ6GEYJ201; Group: Резисторы; Power: 0,125; Type: Type; TU: TU; Precision: ±5%; Manufacturer: Panasonic
pins: 1, 2

## ERJ6GEYJ331
designator R?  value 330
Резистор Panasonic 0805 5% 330Ом; Part Number: Резистор 0805, 0,125Вт, 330Ом±5% ERJ6GEYJ331; Group: Резисторы; Power: 0,125; Type: Type; TU: TU; Precision: ±5%; Manufacturer: Panasonic
pins: 1, 2

## ERJ6GEYJ750
designator R?  value 75
Резистор Panasonic 0805 5% 75Ом; Part Number: Резистор 0805, 0,125Вт, 75Ом±5% ERJ6GEYJ750; Group: Резисторы; Power: 0,125; Type: Type; TU: TU; Precision: ±5%; Manufacturer: Panasonic
pins: 1, 2

## ERJ6RBD1500
designator R?  value 150
Резистор прец Panasonic 0805 0.5% 150Ом; Part Number: Резистор 0805, 0,1Вт, 150Ом±0,5% ERJ6RBD1500; Group: Резисторы; Power: 0,1; Precision: ±0,5%; Type: Type; TU: TU; Manufacturer: Panasonic
pins: 1, 2

## ERJ14YJ100
designator R?  value 10
Резистор Panasonic 1210 5% 10Ом; Part Number: Резистор 1210, 0,5Вт, 10Ом±5% ERJ14YJ100; Group: Резисторы; Power: 0,5; Type: Type; TU: TU; Precision: ±5%; Manufacturer: Panasonic
pins: 1, 2

## ESP32-WROOM-32
designator DD?, comment Type: ESP32-WROOM-32  (hidden comment: Твердотельное реле 90В, 10А)
Модуль ESP32; Manufacturer: ESPRESSIV; Part Number: ESP32-WROOM-32
pins: 1 GND, 2 3V3, 3 EN, 4 SENSOR_VP, 5 SENSOR_VN, 6 IO34, 7 IO35, 8 IO32, 9 IO33, 10 IO25, 11 IO26, 12 IO27, 13 IO14, 14 IO12, 15 GND, 16 IO13, 17 NC, 18 NC, 19 NC, 20 NC, 21 NC, 22 NC, 23 IO15, 24 IO2, 25 IO0, 26 IO4, 27 IO16, 28 IO17, 29 IO5, 30 IO18, 31 IO19, 32 NC, 33 IO21, 34 RXD0, 35 TXD0, 36 IO22, 37 IO23, 38 GND

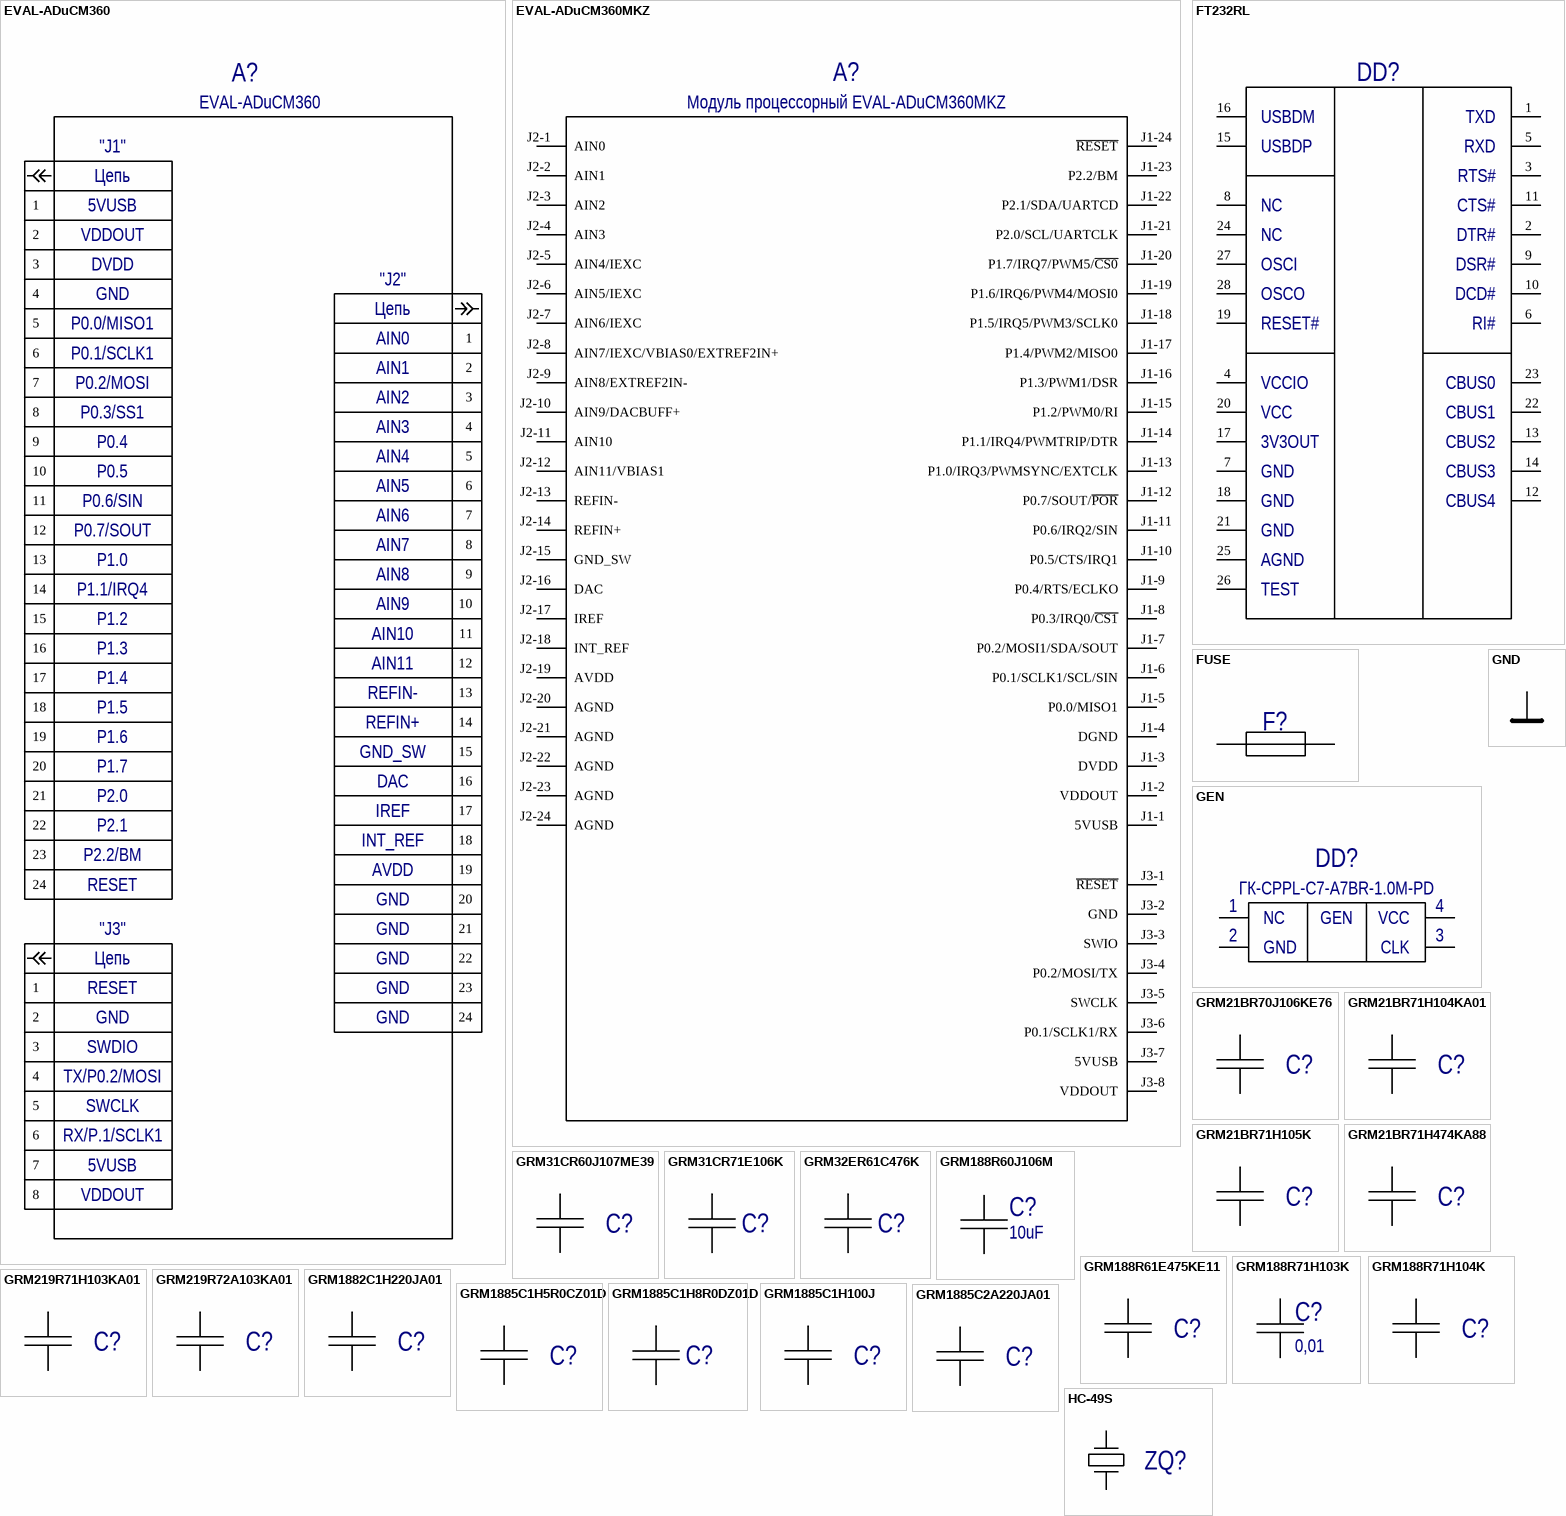
[diagram p16: symbols EVAL-ADuCM360 to HC-49S]

## EVAL-ADuCM360
designator A?
Manufacturer: Analog Devices; Group: Модули радиоэлектронные; Price: 10000; Type: EVAL-ADuCM360
pins: 1, 1, 1, 2, 2, 2, 3, 3, 3, 4, 4, 4, 5, 5, 5, 6, 6, 6, 7, 7, 7, 8, 8, 8, 9, 9, 10, 10, 11, 11, 12, 12, 13, 13, 14, 14, 15, 15, 16, 16, 17, 17, 18, 18, 19, 19, 20, 20, 21, 21, 22, 22, 23, 23, 24, 24
text: "J1"; Цепь; 5VUSB; VDDOUT; DVDD; "J2"; GND; P0.0/MISO1; AIN0; P0.1/SCLK1; AIN1; P0.2/MOSI; AIN2; P0.3/SS1; AIN3; P0.4; AIN4; P0.5; AIN5; P0.6/SIN; AIN6; P0.7/SOUT; AIN7; P1.0; AIN8; P1.1/IRQ4; AIN9; P1.2; AIN10; P1.3; AIN11; P1.4; REFIN-; P1.5; REFIN+; P1.6; GND_SW; P1.7; DAC; P2.0; IREF; P2.1; INT_REF; P2.2/BM; AVDD; RESET; "J3"; SWDIO; TX/P0.2/MOSI; SWCLK; RX/P.1/SCLK1

## EVAL-ADuCM360MKZ
designator A?  Type: Модуль процессорный EVAL-ADuCM360MKZ  (hidden comment: EVAL-ADuCM360MKZ)
Модуль процессорный; Manufacturer: Analog Devices; Price: 10000
pins: J1-1 5VUSB, J1-2 VDDOUT, J1-3 DVDD, J1-4 DGND, J1-5 P0.0/MISO1, J1-6 P0.1/SCLK1/SCL/SIN, J1-7 P0.2/MOSI1/SDA/SOUT, J1-8 P0.3/IRQ0/~{CS1}, J1-9 P0.4/RTS/ECLKO, J1-10 P0.5/CTS/IRQ1, J1-11 P0.6/IRQ2/SIN, J1-12 P0.7/SOUT/~{POR}, J1-13 P1.0/IRQ3/PWMSYNC/EXTCLK, J1-14 P1.1/IRQ4/PWMTRIP/DTR, J1-15 P1.2/PWM0/RI, J1-16 P1.3/PWM1/DSR, J1-17 P1.4/PWM2/MISO0, J1-18 P1.5/IRQ5/PWM3/SCLK0, J1-19 P1.6/IRQ6/PWM4/MOSI0, J1-20 P1.7/IRQ7/PWM5/~{CS0}, J1-21 P2.0/SCL/UARTCLK, J1-22 P2.1/SDA/UARTCD, J1-23 P2.2/BM, J1-24 ~{RESET}, J2-1 AIN0, J2-2 AIN1, J2-3 AIN2, J2-4 AIN3, J2-5 AIN4/IEXC, J2-6 AIN5/IEXC, J2-7 AIN6/IEXC, J2-8 AIN7/IEXC/VBIAS0/EXTREF2IN+, J2-9 AIN8/EXTREF2IN-, J2-10 AIN9/DACBUFF+, J2-11 AIN10, J2-12 AIN11/VBIAS1, J2-13 REFIN-, J2-14 REFIN+, J2-15 GND_SW, J2-16 DAC, J2-17 IREF, J2-18 INT_REF, J2-19 AVDD, J2-20 AGND, J2-21 AGND, J2-22 AGND, J2-23 AGND, J2-24 AGND, J3-1 ~{RESET}, J3-2 GND, J3-3 SWIO, J3-4 P0.2/MOSI/TX, J3-5 SWCLK, J3-6 P0.1/SCLK1/RX, J3-7 5VUSB, J3-8 VDDOUT

## FT232RL
designator DD?  (value not drawn)
Group: Микросхемы; Type: Type; TU: TU
footprint TSSOP28_W7.8
pins: 1, 2, 3, 4, 5, 6, 7, 8, 9, 10, 11, 12, 13, 14, 15, 16, 17, 18, 19, 20, 21, 22, 23, 24, 25, 26, 27, 28
text: USBDM; TXD; USBDP; RXD; RTS#; NC; CTS#; DTR#; OSCI; DSR#; OSCO; DCD#; RESET#; RI#; VCCIO; CBUS0; VCC; CBUS1; 3V3OUT; CBUS2; GND; CBUS3; CBUS4; AGND; TEST

## FUSE
designator F?  (value not drawn)
Group: Group; Type: Type; TU: TU
pins: 1, 2

## GEN
designator DD?, comment Type: ГК-CPPL-C7-A7BR-1.0M-PD  (hidden comment: ГК-CPPL-C7)
Group: Микросхемы; TU: ПГКФ.433526.025 ТУ; FullName: ГК-CPPL-C7-A7BR-1.0M-PD ПГКФ.433526.025 ТУ; Price: 250
pins: 1, 4, 5, 8
text: NC; VCC; 2; GND; CLK; 3

## GND
designator PWR?  (value not drawn)
Group: Group; Type: Type; TU: TU
pins: 0 GND (power)

## GRM21BR70J106KE76
designator C?
Керамический конденсатор Murata 0805, ±10%, 6.3В, X7R; Part Number: Конденсатор 0805, 6,3В, 10мкФ±10%, X7R GRM21BR70J106KE76; Group: Конденсаторы; Value: 10uF; Volt: 6.3; Type: Type; TU: TU; TKE: X7R; Precision: ±10%; Manufacturer: Murata
footprint C0805
pins: 1 0, 2 1

## GRM21BR71H104KA01
designator C?
Керамический конденсатор Murata 0805, ±10%, 50В, X7R; Part Number: Конденсатор 0805, 50В, 0,1мкФ±10%, X7R GRM21BR71H104KA01; Group: Конденсаторы; Value: 0,1; Volt: 50; Type: Type; TU: TU; TKE: X7R; Precision: ±10%; Manufacturer: Murata
footprint C0805
pins: 1 0, 2 1

## GRM21BR71H105K
designator C?
Керамический конденсатор Murata 0805, 1мкФ ±10%, 50В, X7R; Part Number: Конденсатор 0805, 50В, 1мкФ±10%, X7R GRM21BR71H105K; Group: Конденсаторы; Value: 1uF; Volt: 50; Type: Type; TU: TU; TKE: X7R; Precision: ±10%; Manufacturer: Murata
footprint C0805
pins: 1 0, 2 1

## GRM21BR71H474KA88
designator C?
Керамический конденсатор Murata 0805, ±10%, 50В, X7R; Part Number: Конденсатор 0805, 50В, 0,47мкФ±10%, X7R GRM21BR71H474KA88; Group: Конденсаторы; Value: 0,47; Volt: 50; Type: Type; TU: TU; TKE: X7R; Precision: ±10%; Manufacturer: Murata
footprint C0805
pins: 1 0, 2 1

## GRM31CR60J107ME39
designator C?
Керамический конденсатор Murata 0805, ±20%, 6.3В, X5R; Part Number: Конденсатор 0805, 6.3В, 100мкФ±20%, X5R GRM31CR60J107ME39; Group: Конденсаторы; Value: 100uF; Volt: 6.3; Type: Type; TU: TU; TKE: X5R; Precision: ±20%; Manufacturer: Murata
footprint C0805
pins: 1 0, 2 1

## GRM31CR71E106K
designator C?
Керамический конденсатор Murata 1206, 10мкФ±10%, 25В; Part Number: GRM31CR71E106K; Group: Конденсаторы; Value: 10uF; Volt: 25; Precision: ±10%; Type: Type; TU: TU; Manufacturer: Murata
footprint C0805
pins: 1 0, 2 1

## GRM32ER61C476K
designator C?
Керамический конденсатор Murata 1210, 47мкФ±10%, 16В; Part Number: GRM32ER61C476K; Group: Конденсаторы; Value: 47uF; Volt: 16; Precision: ±10%; Type: Type; TU: TU; Manufacturer: Murata
footprint C0805
pins: 1 0, 2 1

## GRM188R60J106M
designator C?  value 10uF
Керамический конденсатор Murata 0603, 10uF±10%, 6.3В; Part Number: GRM188R60J106M; Group: Конденсаторы; Volt: 6.3; Precision: ±20%; Type: Type; TU: TU; Manufacturer: Murata
footprint C0805
pins: 1 0, 2 1

## GRM188R61E475KE11
designator C?  (value not drawn)
0603/4.7u/25V/±10%/X5R; Part Number: GRM188R71H104K; Group: Конденсаторы; Value: 4.7; Volt: 2.5; TKE: X5R; Precision: ±10%; Type: Type; TU: TU
pins: 1, 2

## GRM188R71H103K
designator C?  value 0,01
Керамический конденсатор Murata 0603, 0,01±10%, 6.3В; Part Number: GRM188R71H103K; Group: Конденсаторы; Volt: 50В; Precision: ±10%; Type: Type; TU: TU; Manufacturer: Murata
footprint C0805
pins: 1 0, 2 1

## GRM188R71H104K
designator C?  (value not drawn)
0603/0.1u/50V/±10%; Group: Конденсаторы; Value: 0,1; Volt: 50; Precision: ±10%; Type: Type; TU: TU; TKE: TKE; Part Number: GRM188R71H104K
pins: 1, 2

## GRM219R71H103KA01
designator C?
Керамический конденсатор Murata 0805, ±10%, 50В, X7R; Part Number: Конденсатор 0805, 50В, 0,01мкФ±10%, X7R GRM219R71H103KA01; Group: Конденсаторы; Value: 0,01; Volt: 50; Type: Type; TU: TU; TKE: X7R; Precision: ±10%; Manufacturer: Murata
footprint C0805
pins: 1 0, 2 1

## GRM219R72A103KA01
designator C?
Керамический конденсатор Murata 0805, ±10%, 100В, X7R; Part Number: Конденсатор 0805, 100В, 0,01мкФ±10%, X7R GRM219R72A103KA01; Group: Конденсаторы; Value: 0,01; Volt: 100; Type: Type; TU: TU; TKE: X7R; Precision: ±10%; Manufacturer: Murata
footprint C0805
pins: 1 0, 2 1

## GRM1882C1H220JA01
designator C?
Керамический конденсатор термокомпенс. Murata 0603, ±5%, 50В, CH; Part Number: Конденсатор 0603, 50В, 22пФ±5%,  CH, GRM1882C1H220JA01; Group: Конденсаторы; Value: 22pF; Volt: 50; TKE: CH 0±60ppm/°C; Type: Type; TU: TU; Precision: ±5%; Manufacturer: Murata
footprint C0805
pins: 1 0, 2 1

## GRM1885C1H5R0CZ01D
designator C?  (value not drawn)
0603/5p/50V/C0G; Manufacturer: Murata; Group: Конденсаторы; Value: 5p; Volt: 50; Type: Type; TU: TU; TKE: TKE; Part Number: GRM1885C1H5R0CZ01D
pins: 1, 2

## GRM1885C1H8R0DZ01D
designator C?, comment GRM1885C1H5R0CZ01D  (value not drawn)
0603/8p/50V/C0G; Part Number: GRM1885C1H8R0DZ01D; Manufacturer: Murata; Group: Конденсаторы; Value: 8pF; Volt: 50; Type: Type; TU: TU; TKE: TKE
pins: 1, 2

## GRM1885C1H100J
designator C?  (value not drawn)
0603/10p/50V/±5%; Group: Конденсаторы; Value: 10pF; Volt: 50; Precision: ±5%; Type: Type; TU: TU; TKE: TKE; Part Number: GRM1885C1H100J
pins: 1, 2

## GRM1885C2A220JA01
designator C?
Керамический конденсатор термокомпенс. Murata 0603, ±5%, 100В, C0G; Part Number: Конденсатор 0603, 100В, 22пФ±5%, C0G, GRM1885C2A220JA01; Group: Конденсаторы; Value: 22pF; Volt: 100; TKE: C0G 0±30ppm/°C; Type: Type; TU: TU; Precision: ±5%; Manufacturer: Murata
footprint C0805
pins: 1 0, 2 1

## HC-49S
designator ZQ?  (value not drawn)
Group: Резонаторы кварцевые; Type: Type; TU: TU; Value: Value
footprint HC-49S
pins: 1 0, 2 0

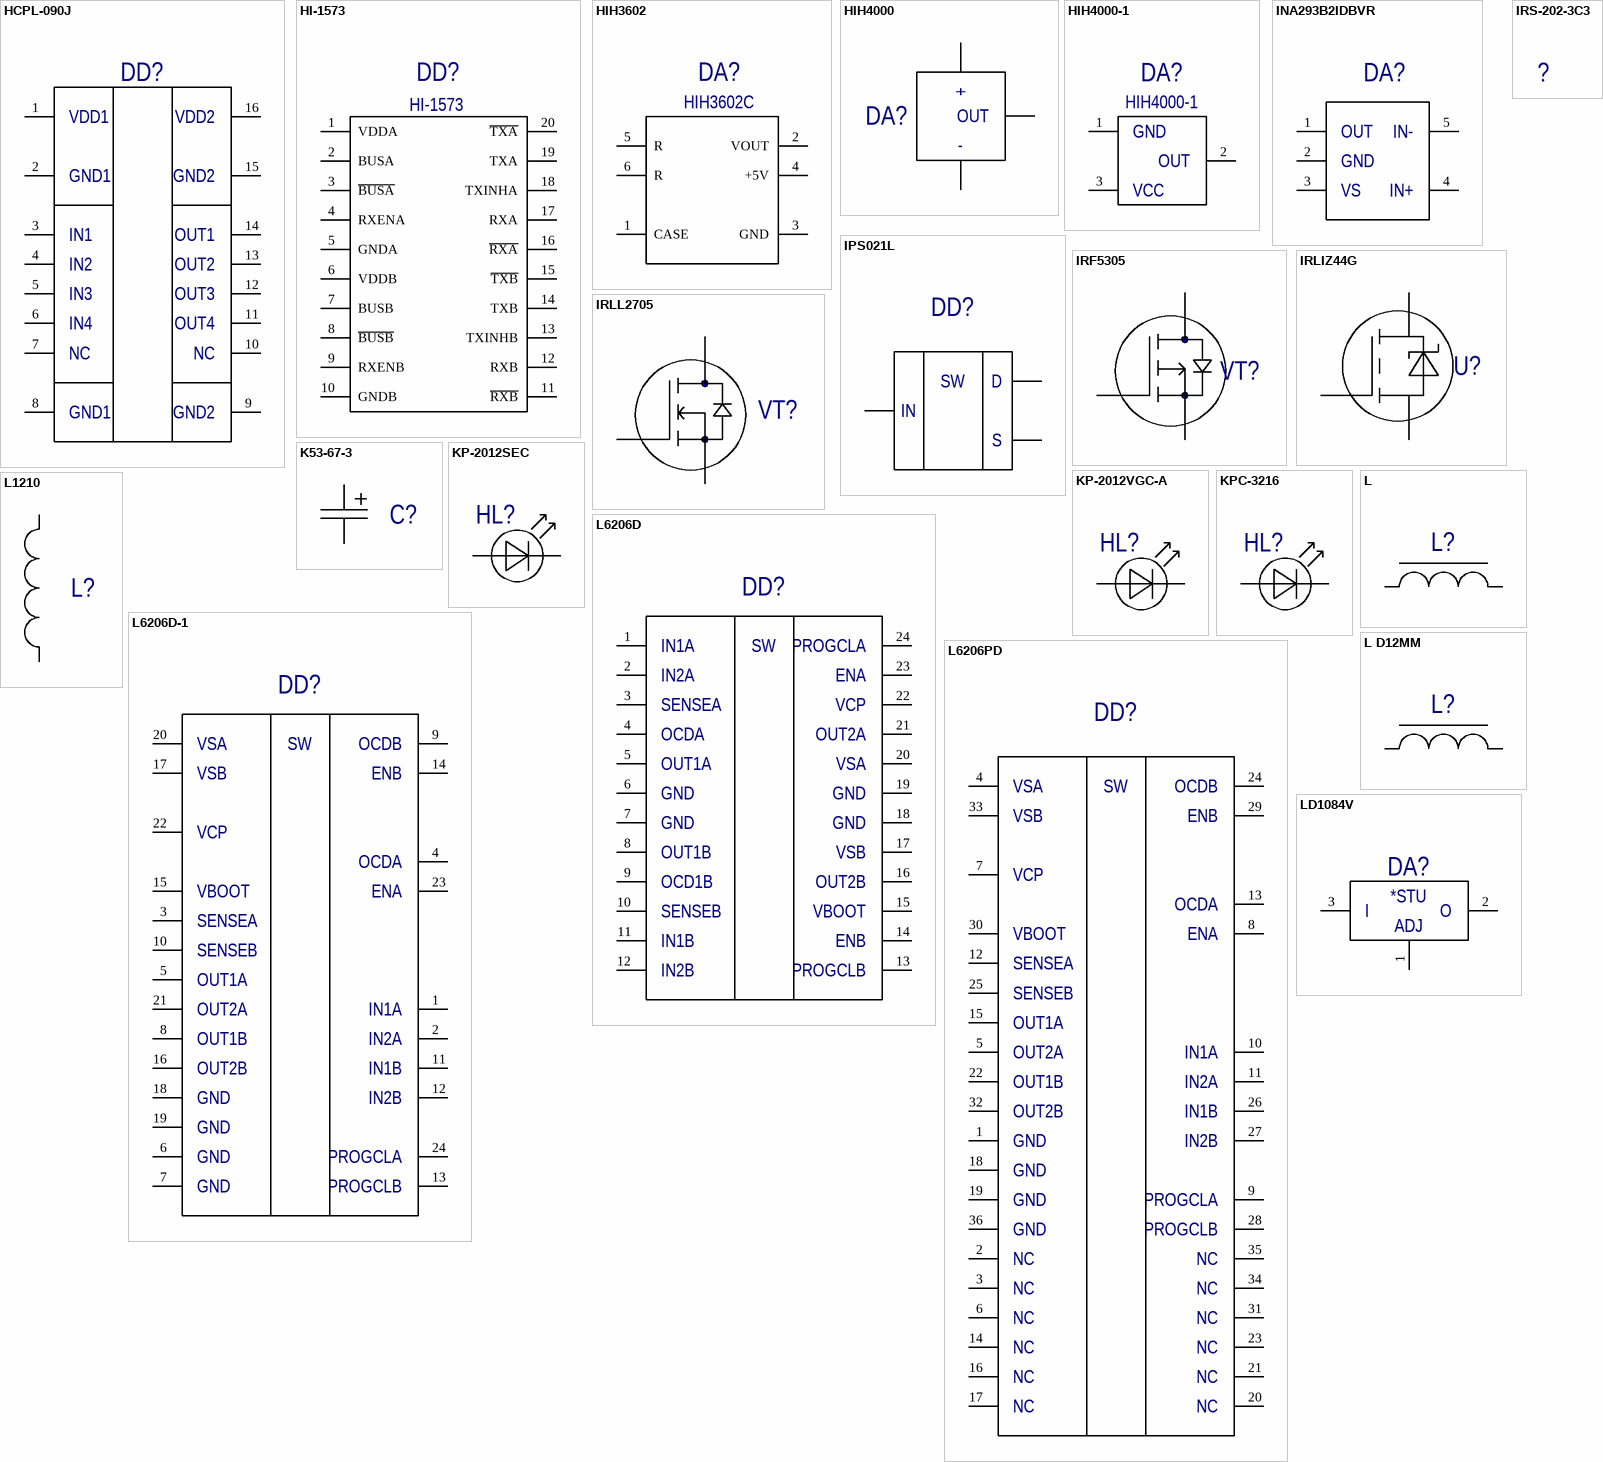
[diagram p17: symbols HCPL-090J to LD1084V]

## HCPL-090J
designator DD?  (value not drawn)
Group: Микросхемы; Type: Type; TU: TU
pins: 1 (power), 2 (power), 3, 4, 5, 6, 7, 8 (power), 9 (power), 10, 11, 12, 13, 14, 15 (power), 16 (power)
text: VDD1; VDD2; GND1; GND2; IN1; OUT1; IN2; OUT2; IN3; OUT3; IN4; OUT4; NC

## HI-1573
designator DD?  Part Number: HI-1573
Приемопередатчик MIL-STD-1553B с принуд уст. выходов в 0; Manufacturer: Holt; Group: Микросхемы; Type: HI-1573
pins: 1 VDDA, 2 BUSA, 3 ~{BUSA}, 4 RXENA, 5 GNDA, 6 VDDB, 7 BUSB, 8 ~{BUSB}, 9 RXENB, 10 GNDB, 11 ~{RXB}, 12 RXB, 13 TXINHB, 14 TXB, 15 ~{TXB}, 16 ~{RXA}, 17 RXA, 18 TXINHA, 19 TXA, 20 ~{TXA}

## HIH3602
designator DA?  Type: HIH3602C  (hidden comment: HIH3602)
Датчик влажности; Manufacturer: Honeywell; Group: Микросхемы; Price: 1000; FullName: HIH3602C
pins: 1 CASE, 2 VOUT, 3 GND, 4 +5V, 5 R, 6 R

## HIH4000
designator DA?  (value not drawn)
Group: Микросхемы; Type: Type; TU: TU
pins: 1, 2, 3
text: +; OUT; -

## HIH4000-1
designator DA?
Group: Микросхемы; TU: TU; Type: Type
pins: 1, 2, 3
text: GND; OUT; VCC

## INA293B2IDBVR
designator DA?, comment INA293  (value not drawn)
–4-V to 110-V, 1.3-MHz, Ultra-Precise Current Sense Amplifier; Part Number: INA293B2IDBVR; Group: Микросхемы; Type: Type; TU: TU
footprint TSSOP28_W7.8
pins: 1, 2, 3, 4, 5
text: OUT; IN-; GND; VS; IN+

## IPS021L
designator DD?  (value not drawn)
Group: Микросхемы; Type: Type; TU: TU
pins: D, IN, S
text: SW

## IRF5305
designator VT?  (value not drawn)
Транзистор p канал ТО220; Group: Транзисторы; Type: Type; TU: TU; FullName: IRF5305; Part Number: IRF5305
footprint TO220
pins: 1 G, 2 D, 3 S

## IRLIZ44G
designator U?  (value not drawn)
Group: Group; Type: Type; TU: TU
pins: 1 0, 2 0, 3 1

## IRLL2705
designator VT?  (value not drawn)
Транзистор n канал SOT-223; Group: Транзисторы; Type: Type; TU: TU; FullName: IRLL2705; Part Number: IRLL2705
pins: 1 G, 2 D, 3 S

## IRS-202-3C3
designator ?  (value not drawn)
Group: Group; Type: Type; TU: TU
footprint IRS-202-3C3

## K53-67-3
designator C?  (value not drawn)
Group: Конденсаторы; Type: Type; TU: TU; Value: Value; Volt: Volt; TKE: TKE; Precision: Precision
pins: 1, 2

## KP-2012SEC
designator HL?  (value not drawn)
Светодиод красный 0805 200мКд; Part Number: KP-2012SEC; Manufacturer: Kingbright; Group: Индикаторы единичные; NameComp: KP-2012SEC; Type: KP-2012SEC
pins: 1, 2

## KP-2012VGC-A
designator HL?  (value not drawn)
Светодиод зеленый 0805 180мКд; Part Number: KP-2012VGC-A; Manufacturer: Kingbright; Group: Индикаторы единичные; NameComp: KP-2012VGC-A; Type: KP-2012VGC-A
pins: 1, 2

## KPC-3216
designator HL?  (value not drawn)
Group: Индикаторы единичные; Type: Type; TU: TU
pins: 1, 2

## L
designator L?  (value not drawn)
Group: Group; Type: Type; TU: TU; Value: Value
pins: 1 0, 2 1

## L1210
designator L?  (value not drawn)
Group: Group; Type: Type; TU: TU; Value: Value
footprint L1210
pins: 1 0, 2 1

## L6206D
designator DD?  (value not drawn)
Group: Микросхемы; Type: Type; TU: TU
footprint L6206D
pins: 1, 2, 3, 4, 5, 6, 7, 8, 9, 10, 11, 12, 13, 14, 15, 16, 17, 18, 19, 20, 21, 22, 23, 24
text: IN1A; SW; PROGCLA; IN2A; ENA; SENSEA; VCP; OCDA; OUT2A; OUT1A; VSA; GND; OUT1B; VSB; OCD1B; OUT2B; SENSEB; VBOOT; IN1B; ENB; IN2B; PROGCLB

## L6206D-1
designator DD?  (value not drawn)
Group: Микросхемы; Type: Type; TU: TU
footprint L6206D
pins: 1, 2, 3, 4, 5, 6, 7, 8, 9, 10, 11, 12, 13, 14, 15, 16, 17, 18, 19, 20, 21, 22, 23, 24
text: VSA; SW; OCDB; VSB; ENB; VCP; OCDA; VBOOT; ENA; SENSEA; SENSEB; OUT1A; OUT2A; IN1A; OUT1B; IN2A; OUT2B; IN1B; GND; IN2B; PROGCLA; PROGCLB

## L6206PD
designator DD?  (value not drawn)
Group: Микросхемы; Type: Type; TU: TU
pins: 1, 2, 3, 4, 5, 6, 7, 8, 9, 10, 11, 12, 13, 14, 15, 16, 17, 18, 19, 20, 21, 22, 23, 24, 25, 26, 27, 28, 29, 30, 31, 32, 33, 34, 35, 36
text: VSA; SW; OCDB; VSB; ENB; VCP; OCDA; VBOOT; ENA; SENSEA; SENSEB; OUT1A; OUT2A; IN1A; OUT1B; IN2A; OUT2B; IN1B; GND; IN2B; PROGCLA; PROGCLB; NC

## L D12MM
designator L?  (value not drawn)
Group: Group; Type: Type; TU: TU; Value: Value
footprint L D12MM
pins: 1 0, 2 1

## LD1084V
designator DA?  (value not drawn)
Group: Микросхемы; Type: Type; TU: TU
pins: 1, 2, 3
text: *STU; I; O; ADJ

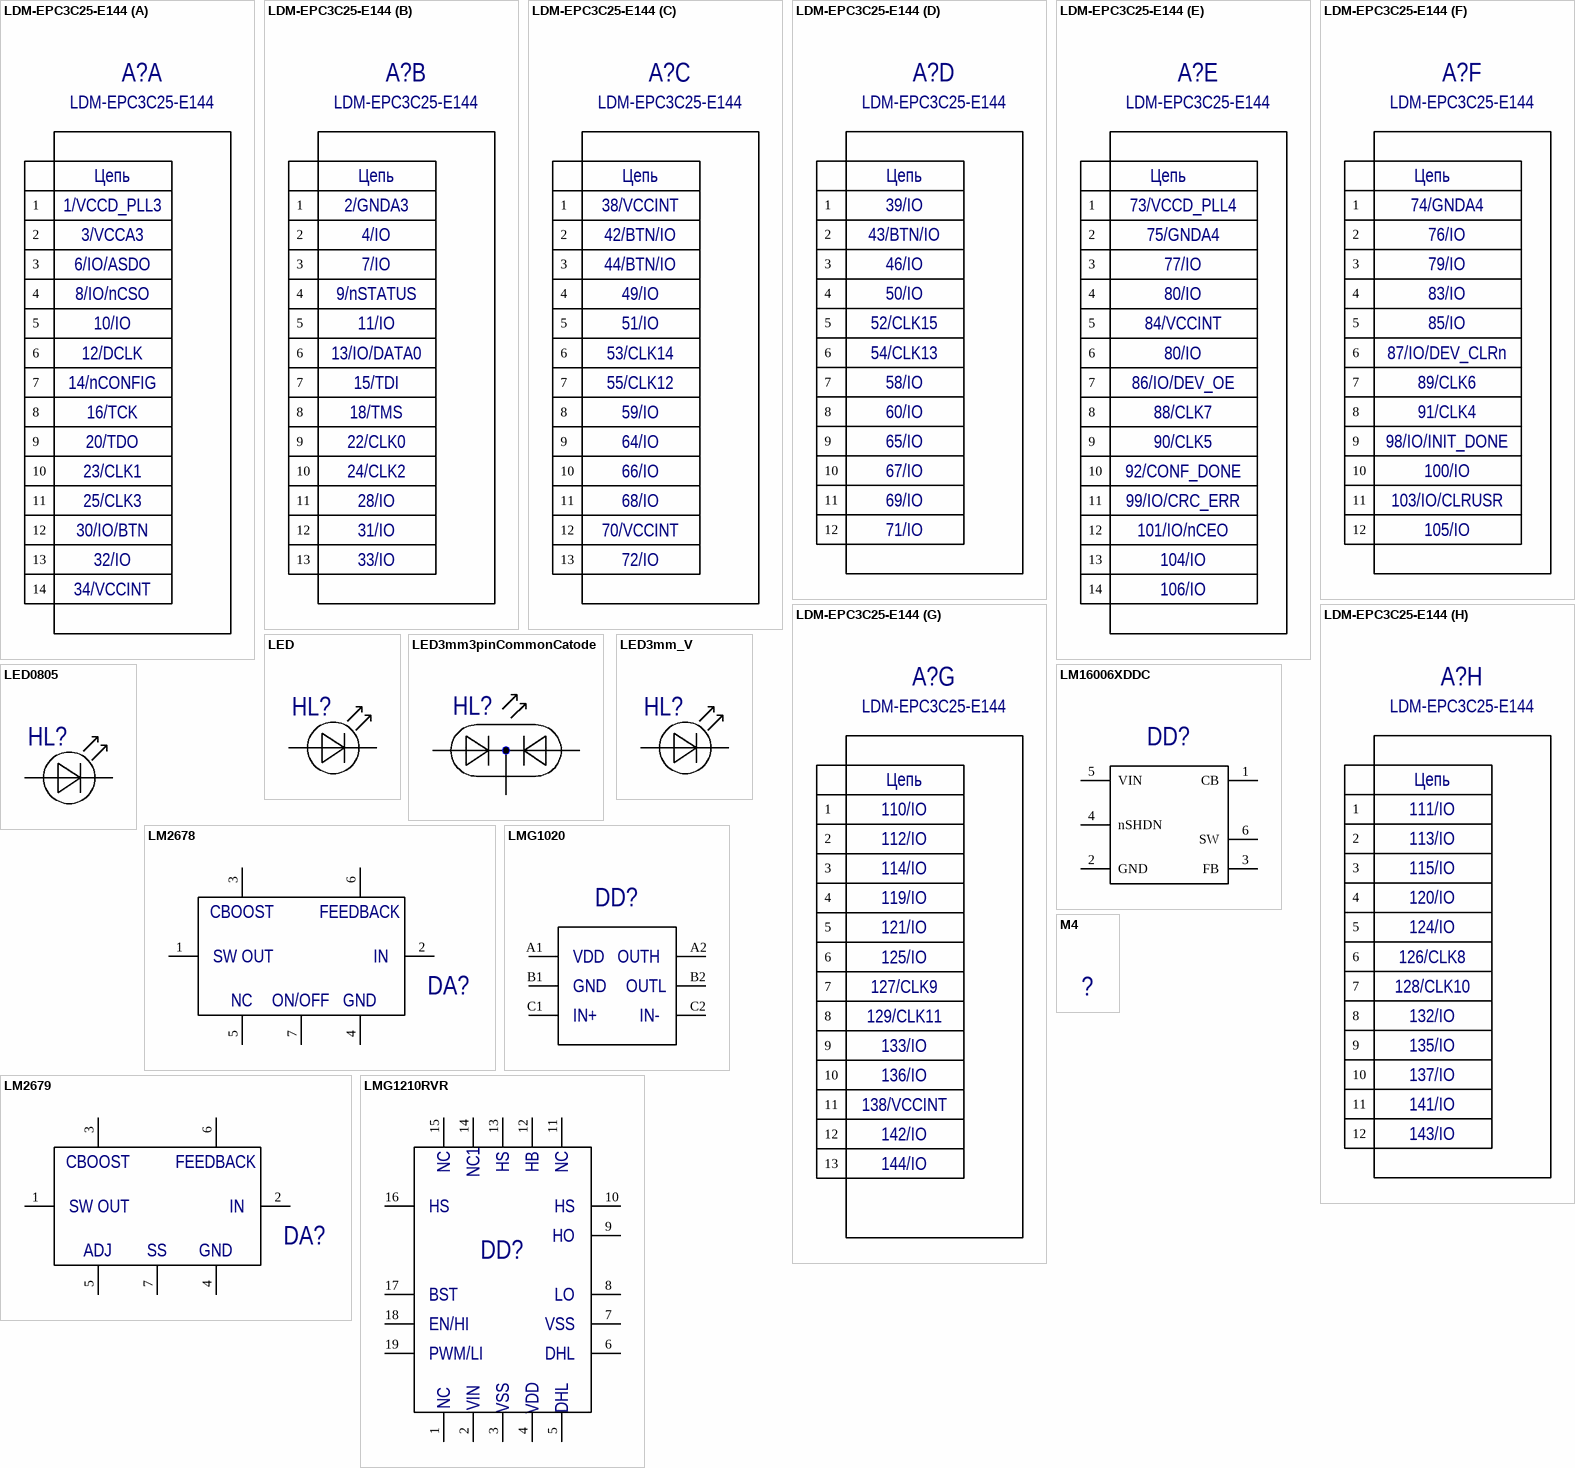
[diagram p18: symbols LDM-EPC3C25-E144 to M4]

## LDM-EPC3C25-E144
designator A?
Manufacturer: LDM-SYSTEMS; Group: Модули радиоэлектронные; Type: LDM-EPC3C25-E144
part A pins: ?1 1, ?2 2, ?3 3, ?4 4, ?5 5, ?6 6, ?7 7, ?8 8, ?9 9, ?10 10, ?11 11, ?12 12, ?13 13, ?14 14
part B pins: ? 1, ? 2, ? 3, ? 4, ? 5, ? 6, ? 7, ? 8, ? 9, ? 10, ? 11, ? 12, ? 13
part C pins: ? 1, ? 2, ? 3, ? 4, ? 5, ? 6, ? 7, ? 8, ? 9, ? 10, ? 11, ? 12, ? 13
part D pins: ? 1, ? 2, ? 3, ? 4, ? 5, ? 6, ? 7, ? 8, ? 9, ? 10, ? 11, ? 12
part E pins: ? 1, ? 2, ? 3, ? 4, ? 5, ? 6, ? 7, ? 8, ? 9, ? 10, ? 11, ? 12, ? 13, ? 14
part F pins: ? 1, ? 2, ? 3, ? 4, ? 5, ? 6, ? 7, ? 8, ? 9, ? 10, ? 11, ? 12
part G pins: ? 1, ? 2, ? 3, ? 4, ? 5, ? 6, ? 7, ? 8, ? 9, ? 10, ? 11, ? 12, ? 13
part H pins: ? 1, ? 2, ? 3, ? 4, ? 5, ? 6, ? 7, ? 8, ? 9, ? 10, ? 11, ? 12
part A text: Цепь; 1/VCCD_PLL3; 3/VCCA3; 6/IO/ASDO; 8/IO/nCSO; 10/IO; 12/DCLK; 14/nCONFIG; 16/TCK; 20/TDO; 23/CLK1; 25/CLK3; 30/IO/BTN; 32/IO; 34/VCCINT
part B text: Цепь; 2/GNDA3; 4/IO; 7/IO; 9/nSTATUS; 11/IO; 13/IO/DATA0; 15/TDI; 18/TMS; 22/CLK0; 24/CLK2; 28/IO; 31/IO; 33/IO
part C text: Цепь; 38/VCCINT; 42/BTN/IO; 44/BTN/IO; 49/IO; 51/IO; 53/CLK14; 55/CLK12; 59/IO; 64/IO; 66/IO; 68/IO; 70/VCCINT; 72/IO
part D text: Цепь; 39/IO; 43/BTN/IO; 46/IO; 50/IO; 52/CLK15; 54/CLK13; 58/IO; 60/IO; 65/IO; 67/IO; 69/IO; 71/IO
part E text: Цепь; 73/VCCD_PLL4; 75/GNDA4; 77/IO; 80/IO; 84/VCCINT; 86/IO/DEV_OE; 88/CLK7; 90/CLK5; 92/CONF_DONE; 99/IO/CRC_ERR; 101/IO/nCEO; 104/IO; 106/IO
part F text: Цепь; 74/GNDA4; 76/IO; 79/IO; 83/IO; 85/IO; 87/IO/DEV_CLRn; 89/CLK6; 91/CLK4; 98/IO/INIT_DONE; 100/IO; 103/IO/CLRUSR; 105/IO
part G text: Цепь; 110/IO; 112/IO; 114/IO; 119/IO; 121/IO; 125/IO; 127/CLK9; 129/CLK11; 133/IO; 136/IO; 138/VCCINT; 142/IO; 144/IO
part H text: Цепь; 111/IO; 113/IO; 115/IO; 120/IO; 124/IO; 126/CLK8; 128/CLK10; 132/IO; 135/IO; 137/IO; 141/IO; 143/IO

## LED
designator HL?  (value not drawn)
Part Number: *; NameComp: *
pins: 1, 2

## LED3mm3pinCommonCatode
designator HL?  (value not drawn)
Part Number: Светодиод 3мм двухцветный с общим катодом; Group: Индикаторы единичные; Type: Type; TU: TU
footprint LED3mm3pinCommonCatode
pins: 1 A1, 2 A2, 3 C

## LED3mm_V
designator HL?  (value not drawn)
Part Number: Светодиод 3мм; Group: Индикаторы единичные; Type: Type; TU: TU
footprint LED3mm_V_GREEN
footprint LED3mm_V_GREEN
pins: 1, 2

## LED0805
designator HL?  (value not drawn)
Group: Индикаторы единичные; Type: Type; TU: TU
footprint LED 0805
pins: 1, 2

## LM2678
designator DA?  (value not drawn)
Group: Микросхемы; Type: Type; TU: TU
footprint LM2679T
pins: 1, 2, 3, 4, 5, 6, 7
text: CBOOST; FEEDBACK; SW OUT; IN; NC; ON/OFF; GND

## LM2679
designator DA?  (value not drawn)
Group: Микросхемы; Type: Type; TU: TU
footprint LM2679T
pins: 1, 2, 3, 4, 5, 6, 7
text: CBOOST; FEEDBACK; SW OUT; IN; ADJ; SS; GND

## LM16006XDDC
designator DD?, comment LM16006  (value not drawn)
LMR16006 SIMPLE SWITCHER® 60 V 0.6 A Buck Regulators; Manufacturer: Texas Instruments; Group: Микросхемы; FullName: LM16006XDDC; Type: Type; TU: TU; Part Number: LM16006XDDC
pins: 1 CB, 2 GND, 3 FB, 4 nSHDN, 5 VIN, 6 SW

## LMG1020
designator DD?  (value not drawn)
5-V, 7-A, 5-A Low-Side GaN and MOSFET Driver For 1-ns Pulse Width Applications; Group: Микросхемы; Type: Type; TU: TU; Part Number: LMG1020
footprint TSSOP28_W7.8
pins: A1, A2, B1, B2, C1, C2
text: VDD; OUTH; GND; OUTL; IN+; IN-

## LMG1210RVR
designator DD?  (value not drawn)
LMG1210 200-V, 1.5-A, 3-A half-bridge MOSFET and GaN FET driver with Adjustable dead time for applications up to 50 MHz; Group: Микросхемы; Type: Type; TU: TU; Part Number: LMG1210RVR
footprint TSSOP28_W7.8
pins: 1, 2, 3, 4, 5, 6, 7, 8, 9, 10, 11, 12, 13, 14, 15, 16, 17, 18, 19
text: NC; NC1; HS; HB; HO; BST; LO; EN/HI; VSS; PWM/LI; DHL; VIN; VDD

## M4
designator ?  (value not drawn)
Group: Group; Type: Type; TU: TU
footprint M4

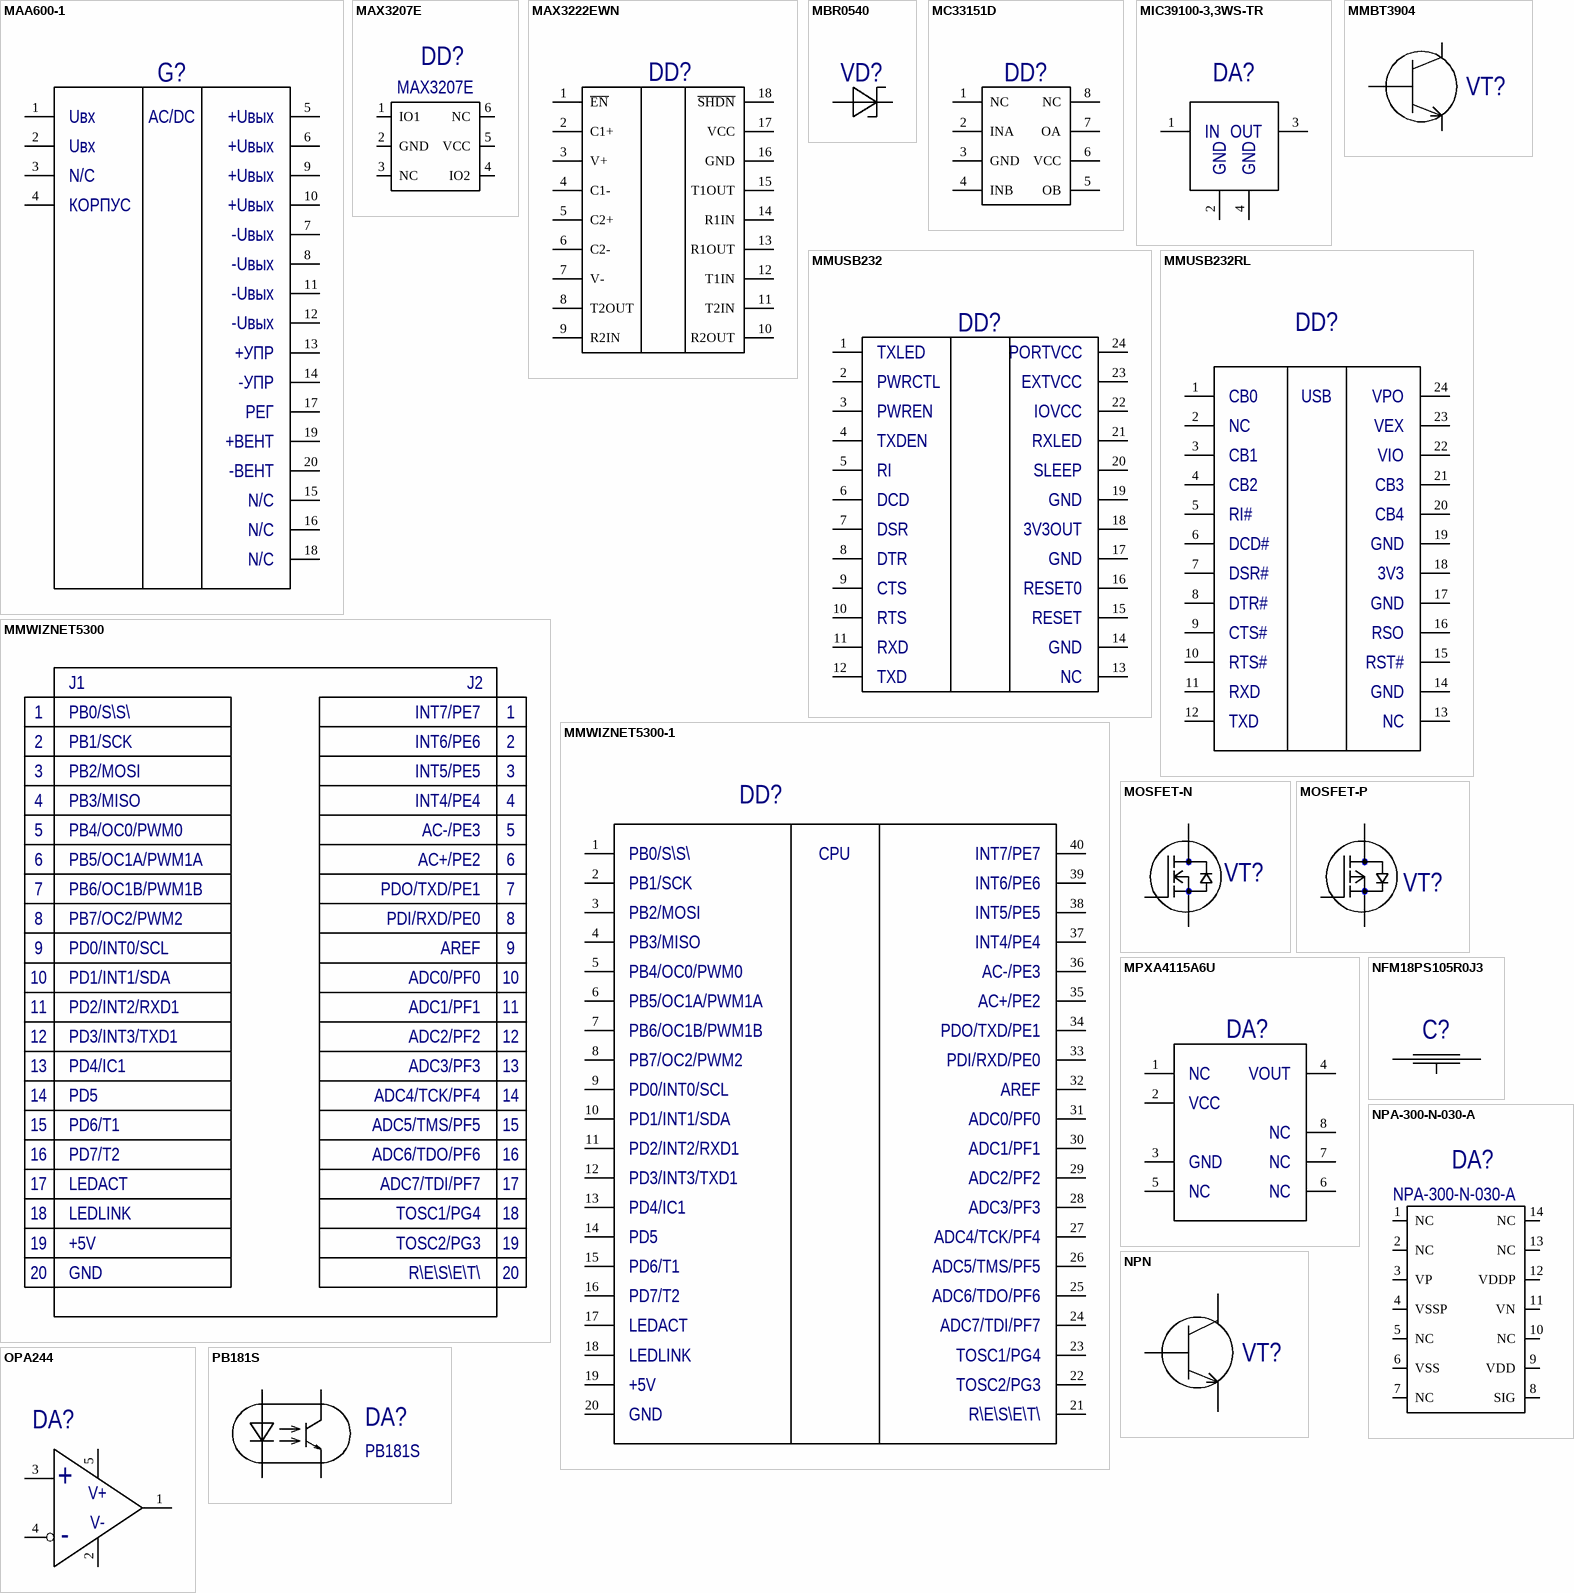
[diagram p19: symbols MAA600-1 to PB181S]

## MAA600-1
designator G?  (value not drawn)
Group: Модули питания; Type: Type; TU: TU
pins: 1, 2, 3, 4, 5, 6, 7, 8, 9, 10, 11, 12, 13, 14, 15, 16, 17, 18, 19, 20
text: Uвх; AC/DC; +Uвых; N/C; КОРПУС; -Uвых; +УПР; -УПР; РЕГ; +ВЕНТ; -ВЕНТ

## MAX3207E
designator DD?  Type: MAX3207E
Микросхема защиты от ESD 2 канала; Manufacturer: Maxim; Group: Микросхемы; TU: TU; Part Number: MAX3207E
pins: 1 IO1, 2 GND, 3 NC, 4 IO2, 5 VCC, 6 NC

## MAX3222EWN
designator DD?
Приемопередатчик RS232 с питанием от 3В; Manufacturer: Maxim; Group: Микросхемы; FullName: MAX3222EWN; Type: Type; TU: TU; Part Number: MAX3222EWN
pins: 1 ~{EN} (power), 2 C1+ (power), 3 V+ (power), 4 C1- (power), 5 C2+ (power), 6 C2- (power), 7 V- (power), 8 T2OUT (power), 9 R2IN (power), 10 R2OUT (power), 11 T2IN (power), 12 T1IN (power), 13 R1OUT (power), 14 R1IN (power), 15 T1OUT (power), 16 GND (power), 17 VCC (power), 18 ~{SHDN} (power)

## MBR0540
designator VD?, comment Диод Шоттки 40V, 500mA SOD123  (value not drawn)
Part Number: MBR0540; Group: Диоды; Type: Type; TU: TU
footprint SODFL370X125-2N (SODFL, 2-Leads, Body 1,60x3,70mm, IPC Medium Density)
pins: 1, 2

## MC33151D
designator DD?  (value not drawn)
2 канальный драйвер затвора MOSFET; Group: Микросхемы; Type: Type; TU: TU; FullName: MC33151; Part Number: MC33151
footprint DIP14-RUS
pins: 1 NC (power), 2 INA (power), 3 GND (power), 4 INB (power), 5 OB (power), 6 VCC (power), 7 GND (power) hidden, 7 OA (power), 8 NC (power), 14 VCC (power) hidden

## MIC39100-3,3WS-TR
designator DA?
Линейный стабилизатор 3,3В/1А SOT223; Part Number: MIC39100-3,3WS-TR; Manufacturer: Micrel; Group: Микросхемы; Type: Type; TU: TU
footprint RM-10
pins: 1, 2, 3, 4
text: IN; OUT; GND

## MMBT3904
designator VT?  (value not drawn)
MMBT3904, Транзистор NPN 40В 0.2А [SOT-23-3]; Part Number: Транзистор MMBT3904; Group: Транзисторы; Type: MMBT3904; TU: TU; FullName: MMBT3904
footprint SOT95P245X110-3N (SOT23, 3-Leads, Body 2,90x2,45mm, Pitch 0,95mm, IPC Medium Density)
pins: 1 B, 2 E, 3 C

## MMUSB232
designator DD?  (value not drawn)
Group: Микросхемы; Type: Type; TU: TU
footprint MMUSB232
pins: 1, 2, 3, 4, 5, 6, 7, 8, 9, 10, 11, 12, 13, 14, 15, 16, 17, 18, 19, 20, 21, 22, 23, 24
text: TXLED; PORTVCC; PWRCTL; EXTVCC; PWREN; IOVCC; TXDEN; RXLED; RI; SLEEP; DCD; GND; DSR; 3V3OUT; DTR; CTS; RESET0; RTS; RESET; RXD; TXD; NC

## MMUSB232RL
designator DD?  (value not drawn)
Group: Микросхемы; Type: Type; TU: TU
pins: 1, 2, 3, 4, 5, 6, 7, 8, 9, 10, 11, 12, 13, 14, 15, 16, 17, 18, 19, 20, 21, 22, 23, 24
text: CB0; USB; VPO; NC; VEX; CB1; VIO; CB2; CB3; RI#; CB4; DCD#; GND; DSR#; 3V3; DTR#; CTS#; RSO; RTS#; RST#; RXD; TXD

## MMWIZNET5300
designator U?  (value not drawn)
Group: Group; Type: Type; TU: TU
pins: 1 0, 2 1, 3 2, 4 3, 5 4, 6 5, 7 6, 8 7, 9 8, 10 9, 11 10, 12 11, 13 12, 14 13, 15 14, 16 15, 17 16, 18 17, 19 18, 20 19, 21 20, 22 21, 23 22, 24 23, 25 24, 26 25, 27 26, 28 27, 29 28, 30 29, 31 30, 32 31, 33 32, 34 33, 35 34, 36 35, 37 36, 38 37, 39 38, 40 39
text: J1; J2; PB0/S\S\; INT7/PE7; PB1/SCK; INT6/PE6; PB2/MOSI; INT5/PE5; PB3/MISO; INT4/PE4; PB4/OC0/PWM0; AC-/PE3; PB5/OC1A/PWM1A; AC+/PE2; PB6/OC1B/PWM1B; PDO/TXD/PE1; PB7/OC2/PWM2; PDI/RXD/PE0; PD0/INT0/SCL; AREF; PD1/INT1/SDA; ADC0/PF0; PD2/INT2/RXD1; ADC1/PF1; PD3/INT3/TXD1; ADC2/PF2; PD4/IC1; ADC3/PF3; PD5; ADC4/TCK/PF4; PD6/T1; ADC5/TMS/PF5; PD7/T2; ADC6/TDO/PF6; LEDACT; ADC7/TDI/PF7; LEDLINK; TOSC1/PG4; +5V; TOSC2/PG3; GND; R\E\S\E\T\

## MMWIZNET5300-1
designator DD?  (value not drawn)
Group: Микросхемы; Type: Type; TU: TU
footprint MMWIZNET5300
pins: 1 0, 2 1, 3 2, 4 3, 5 4, 6 5, 7 6, 8 7, 9 8, 10 9, 11 10, 12 11, 13 12, 14 13, 15 14, 16 15, 17 16, 18 17, 19 18, 20 19, 21 20, 22 21, 23 22, 24 23, 25 24, 26 25, 27 26, 28 27, 29 28, 30 29, 31 30, 32 31, 33 32, 34 33, 35 34, 36 35, 37 36, 38 37, 39 38, 40 39
text: PB0/S\S\; CPU; INT7/PE7; PB1/SCK; INT6/PE6; PB2/MOSI; INT5/PE5; PB3/MISO; INT4/PE4; PB4/OC0/PWM0; AC-/PE3; PB5/OC1A/PWM1A; AC+/PE2; PB6/OC1B/PWM1B; PDO/TXD/PE1; PB7/OC2/PWM2; PDI/RXD/PE0; PD0/INT0/SCL; AREF; PD1/INT1/SDA; ADC0/PF0; PD2/INT2/RXD1; ADC1/PF1; PD3/INT3/TXD1; ADC2/PF2; PD4/IC1; ADC3/PF3; PD5; ADC4/TCK/PF4; PD6/T1; ADC5/TMS/PF5; PD7/T2; ADC6/TDO/PF6; LEDACT; ADC7/TDI/PF7; LEDLINK; TOSC1/PG4; +5V; TOSC2/PG3; GND; R\E\S\E\T\

## MOSFET-N
designator VT?  (value not drawn)
Group: Транзисторы; Type: Type; TU: TU
pins: 1 0, 2 0, 3 1

## MOSFET-P
designator VT?  (value not drawn)
Group: Транзисторы; Type: Type; TU: TU
pins: 1 0, 2 0, 3 1

## MPXA4115A6U
designator DA?  (value not drawn)
Group: Микросхемы; Type: Type; TU: TU
pins: 1, 2, 3, 4, 5, 6, 7, 8
text: NC; VOUT; VCC; GND

## NFM18PS105R0J3
designator C?
Керамический трехвыводный конденсатор Murata 0603, 6,3В 1мкф±20%; Part Number: Конденсатор трехвыводный 0603, 6,3В, 1мкф±20% NFM18PS105R0J3; Group: Конденсаторы; Value: 1uF; Volt: 6,3В; Precision: ±20%; Type: Type; TU: TU; Manufacturer: Murata
pins: 1, 2, 3

## NPA-300-N-030-A
designator DA?, comment Type: NPA-300-N-030-A  (hidden comment: Приемопередатчик RS-485)
Датчик давления 200 кПа, 3,3В, аналог. выход; Manufacturer: General Electric; Group: Микросхемы; Part Number: NPA-300-N-030-A
pins: 1 NC, 2 NC, 3 VP, 4 VSSP, 5 NC, 6 VSS, 7 NC, 8 SIG, 9 VDD, 10 NC, 11 VN, 12 VDDP, 13 NC, 14 NC

## NPN
designator VT?  (value not drawn)
Group: Транзисторы; Type: Type; TU: TU
pins: 1 0, 2 0, 3 1

## OPA244
designator DA?  (value not drawn)
Операционный усилитель SOT-23-5, +2,2...+36V (+-1.1...+-18V); Manufacturer: Burr-Brown; Group: Микросхемы; Type: Type; TU: TU; Part Number: OPA244
footprint TSSOP28_W7.8
pins: 1, 2, 3, 4 (oc), 5
text: +; V+; V-; -

## PB181S
designator DA?, comment Part Number: PB181S  (hidden comment: ОПТРОН)
Транзисторнвя оптопара SOP4, 60В, 50мА, 3мкс; Manufacturer: Протон; Group: Group; Type: Type; TU: TU; FullName: PB181S
pins: 1, 2, 3, 4

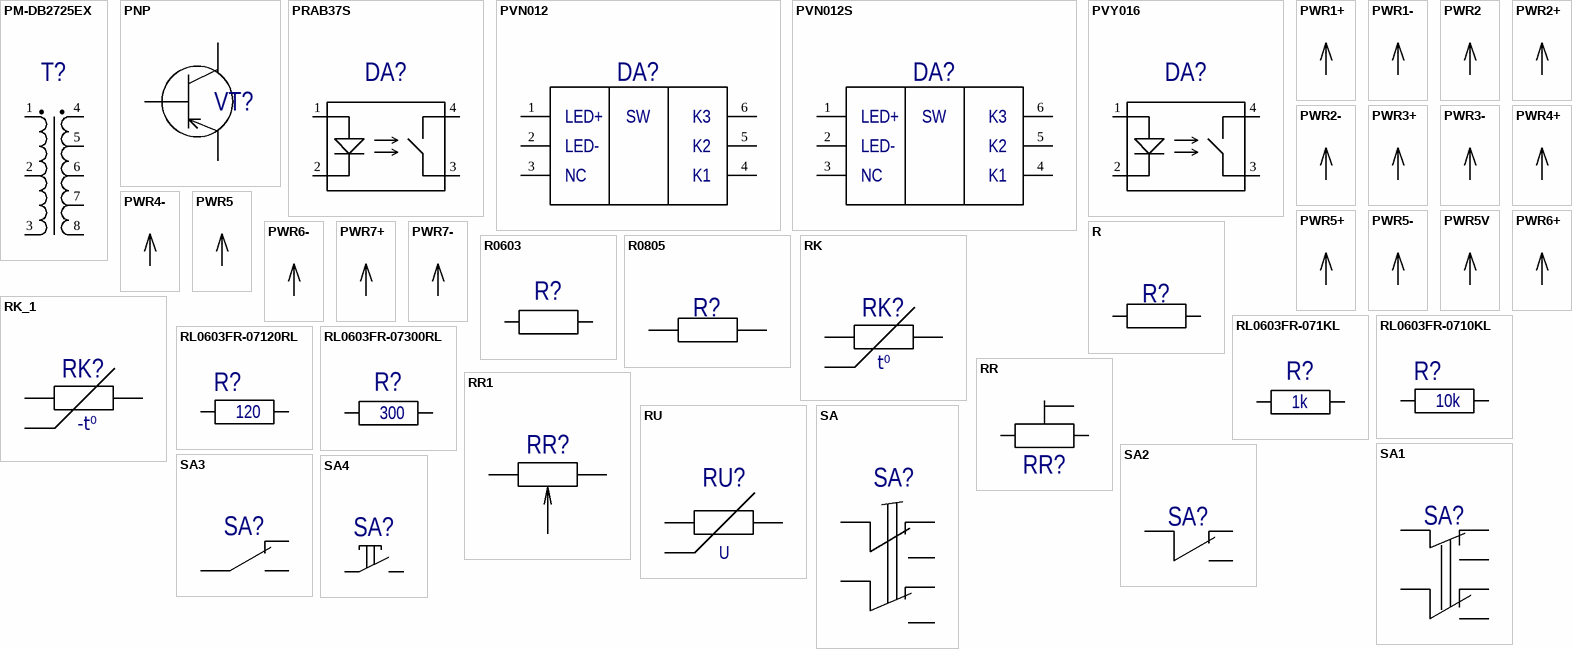
[diagram p20: symbols PM-DB2725EX to SA4]

## PM-DB2725EX
designator T?
Трансформатор изолирующий MIL-STD1553B; Part Number: Трансформатор изолирующий PM-DB2725EX; Manufacturer: Premier Magnetics; Group: Трансформаторы; Type: PM-DB2725EX; TU: TU
pins: 1, 2, 3, 4, 5, 6, 7, 8
text: .

## PNP
designator VT?  (value not drawn)
Group: Транзисторы; Type: Type; TU: TU
pins: 1 0, 2 0, 3 1

## PRAB37S
designator DA?, comment PVN012S  (value not drawn)
Реле твердотельное 60В, 350мА, SO4; Manufacturer: Протон; Group: Микросхемы; FullName: PRAB37S; Type: PRAB37S; TU: TU; Part Number: PRAB37S
pins: 1 0, 2 1, 3 2, 4 3

## PVN012
designator DA?  (value not drawn)
Group: Микросхемы; Type: Type; TU: TU
footprint PVN012
pins: 1 0, 2 1, 3 2, 4 3, 5 4, 6 5
text: LED+; SW; K3; LED-; K2; NC; K1

## PVN012S
designator DA?  (value not drawn)
Group: Микросхемы; Type: Type; TU: TU
footprint PVN012S
pins: 1 0, 2 1, 3 2, 4 3, 5 4, 6 5
text: LED+; SW; K3; LED-; K2; NC; K1

## PVY016
designator DA?, comment PVN012S  (value not drawn)
Реле твердотельное 40В, 300мА, SO4; Manufacturer: International Rectifier; Group: Микросхемы; FullName: PVY016; Type: PVY016; TU: TU; Part Number: PVY016
pins: 1 0, 2 1, 3 2, 4 3

## PWR1+
designator PWR?  (value not drawn)
Group: Group; Type: Type; TU: TU
pins: 0 PWR1+ (power)

## PWR1-
designator PWR?  (value not drawn)
Group: Group; Type: Type; TU: TU
pins: 0 PWR1- (power)

## PWR2
designator U?  (value not drawn)
Group: Group; Type: Type; TU: TU
pins: 0

## PWR2+
designator PWR?  (value not drawn)
Group: Group; Type: Type; TU: TU
pins: 0 PWR2+ (power)

## PWR2-
designator PWR?  (value not drawn)
Group: Group; Type: Type; TU: TU
pins: 0 PWR2- (power)

## PWR3+
designator PWR?  (value not drawn)
Group: Group; Type: Type; TU: TU
pins: 0 PWR3+ (power)

## PWR3-
designator PWR?  (value not drawn)
Group: Group; Type: Type; TU: TU
pins: 0 PWR3- (power)

## PWR4+
designator PWR?  (value not drawn)
Group: Group; Type: Type; TU: TU
pins: 0 PWR4+ (power)

## PWR4-
designator PWR?  (value not drawn)
Group: Group; Type: Type; TU: TU
pins: 0 PWR4- (power)

## PWR5
designator PWR?  (value not drawn)
Group: Group; Type: Type; TU: TU
pins: 0 PWR5 (power)

## PWR5+
designator PWR?  (value not drawn)
Group: Group; Type: Type; TU: TU
pins: 0 PWR5+ (power)

## PWR5-
designator PWR?  (value not drawn)
Group: Group; Type: Type; TU: TU
pins: 0 PWR5- (power)

## PWR5V
designator PWR?  (value not drawn)
Group: Group; Type: Type; TU: TU
pins: 0 PWR5V (power)